# Altium schematic symbol library AliPadash.SchLib: 1117 symbols (part 5 of 6)
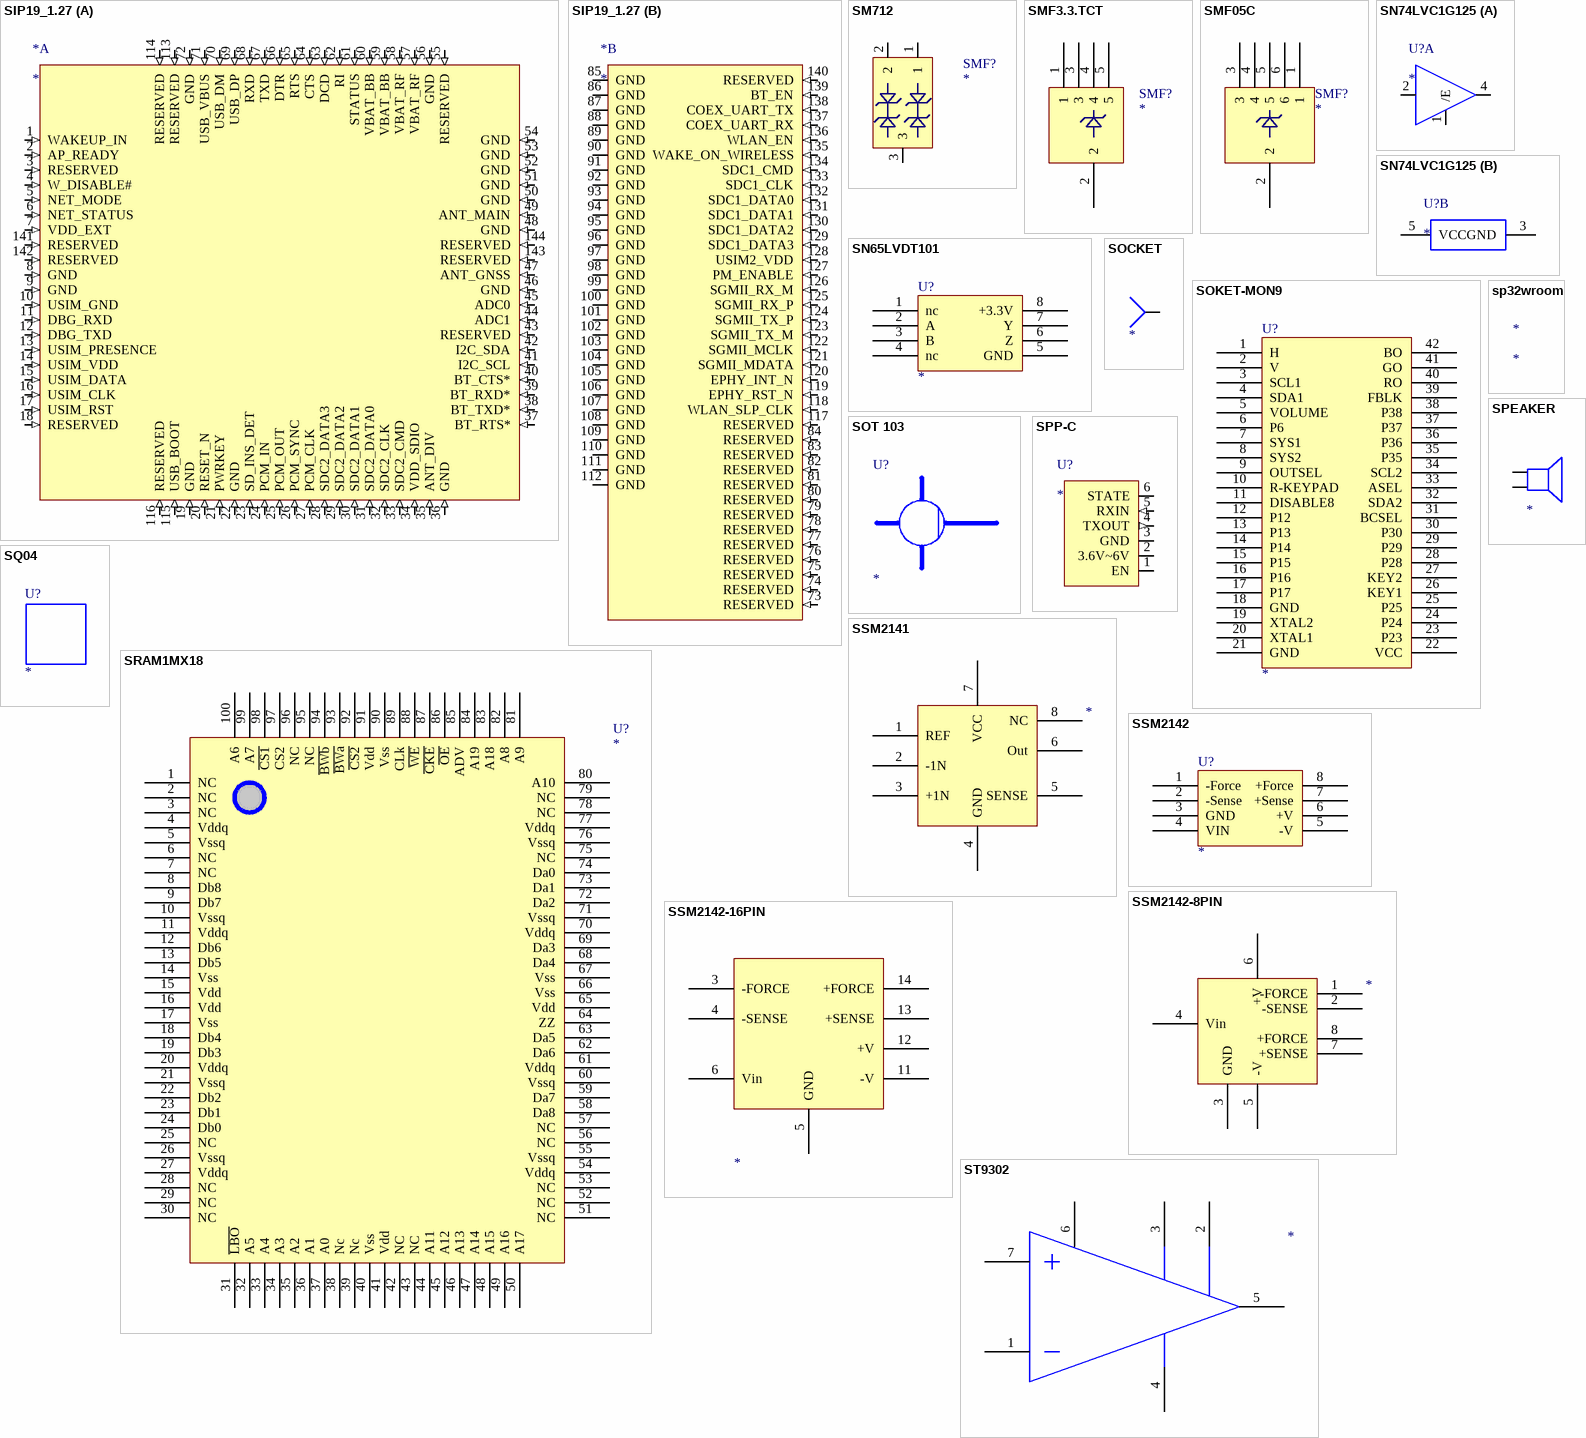
[diagram p87: symbols SIP19_1.27 to ST9302]

## SSM2142-16PIN
designator ?
U?
footprint DIP16
pins: 3 -FORCE, 4 -SENSE, 5 GND (power), 6 Vin, 11 -V, 12 +V, 13 +SENSE, 14 +FORCE

## ST9302
designator ?
pins: 1, 2, 3, 4, 5, 6, 7

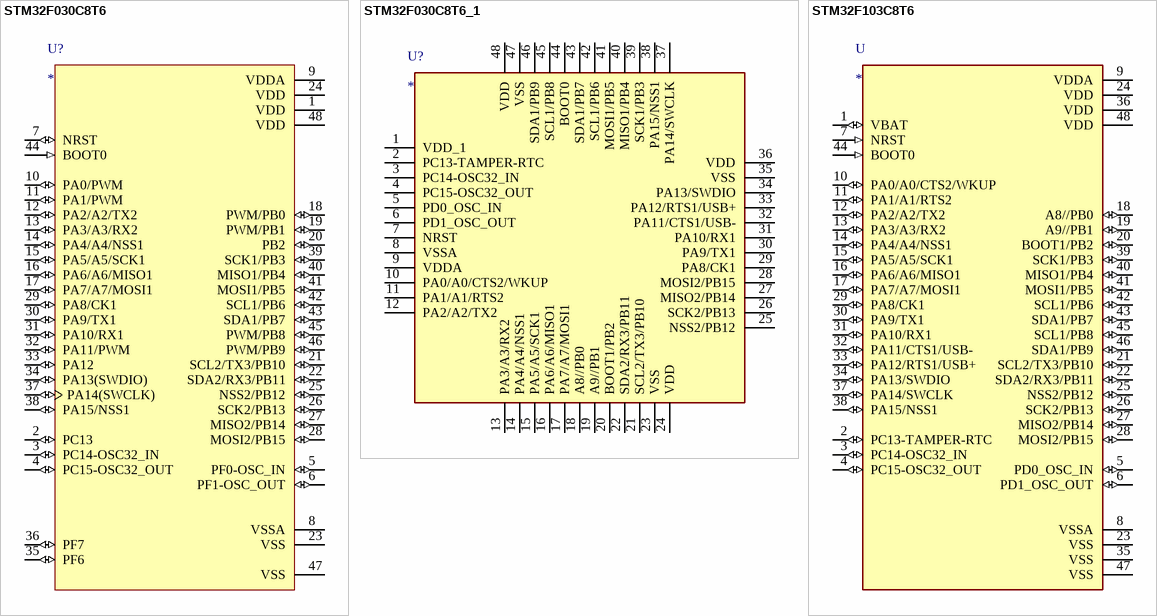
[diagram p58: symbols STM32F030C8T6 to STM32F103C8T6]

## STM32F030C8T6
designator U?
footprint LQFP48
pins: 1 VDD (power), 2 PC13 (io), 3 PC14-OSC32_IN (io), 4 PC15-OSC32_OUT (io), 5 PF0-OSC_IN (io), 6 PF1-OSC_OUT (io), 7 NRST (io), 8 VSSA (power), 9 VDDA (power), 10 PA0/PWM (io), 11 PA1/PWM (io), 12 PA2/A2/TX2 (io), 13 PA3/A3/RX2 (io), 14 PA4/A4/NSS1 (io), 15 PA5/A5/SCK1 (io), 16 PA6/A6/MISO1 (io), 17 PA7/A7/MOSI1 (io), 18 PWM/PB0 (io), 19 PWM/PB1 (io), 20 PB2 (io), 21 SCL2/TX3/PB10 (io), 22 SDA2/RX3/PB11 (io), 23 VSS (power), 24 VDD (power), 25 NSS2/PB12 (io), 26 SCK2/PB13 (io), 27 MISO2/PB14 (io), 28 MOSI2/PB15 (io), 29 PA8/CK1 (io), 30 PA9/TX1 (io), 31 PA10/RX1 (io), 32 PA11/PWM (io), 33 PA12 (io), 34 PA13(SWDIO) (io), 35 PF6 (io), 36 PF7 (io), 37 PA14(SWCLK) (io), 38 PA15/NSS1 (io), 39 SCK1/PB3 (io), 40 MISO1/PB4 (io), 41 MOSI1/PB5 (io), 42 SCL1/PB6 (io), 43 SDA1/PB7 (io), 44 BOOT0 (in), 45 PWM/PB8 (io), 46 PWM/PB9 (io), 47 VSS (power), 48 VDD (power)

## STM32F030C8T6_1
designator U?
footprint LQFP48
pins: 1 VDD_1, 2 PC13-TAMPER-RTC, 3 PC14-OSC32_IN, 4 PC15-OSC32_OUT, 5 PD0_OSC_IN, 6 PD1_OSC_OUT, 7 NRST, 8 VSSA, 9 VDDA, 10 PA0/A0/CTS2/WKUP, 11 PA1/A1/RTS2, 12 PA2/A2/TX2, 13 PA3/A3/RX2, 14 PA4/A4/NSS1, 15 PA5/A5/SCK1, 16 PA6/A6/MISO1, 17 PA7/A7/MOSI1, 18 A8//PB0, 19 A9//PB1, 20 BOOT1/PB2, 21 SCL2/TX3/PB10, 22 SDA2/RX3/PB11, 23 VSS, 24 VDD, 25 NSS2/PB12, 26 SCK2/PB13, 27 MISO2/PB14, 28 MOSI2/PB15, 29 PA8/CK1, 30 PA9/TX1, 31 PA10/RX1, 32 PA11/CTS1/USB-, 33 PA12/RTS1/USB+, 34 PA13/SWDIO, 35 VSS, 36 VDD, 37 PA14/SWCLK, 38 PA15/NSS1, 39 SCK1/PB3, 40 MISO1/PB4, 41 MOSI1/PB5, 42 SCL1/PB6, 43 SDA1/PB7, 44 BOOT0, 45 SCL1/PB8, 46 SDA1/PB9, 47 VSS, 48 VDD

## STM32F103C8T6
designator U
M3 STM32F1 Microcontroller IC 32-Bit 72MHz 64KB _64K x 8_ FLASH; MP: STM32F103C8T6; MF: STMicroelectronics; Price: None; Package: LQFP-48 STMicroelectronics; Value: *; Availability: Unavailable; SnapEDA_Link: https://www.snapeda.com/parts/STM32F103C8T6/STMicroelectronics/view-part/52195/?ref=snap
footprint QFP50P900X900X160-48N
pins: 1 VBAT (io), 2 PC13-TAMPER-RTC (io), 3 PC14-OSC32_IN (io), 4 PC15-OSC32_OUT (io), 5 PD0_OSC_IN (io), 6 PD1_OSC_OUT (io), 7 NRST (in), 8 VSSA (power), 9 VDDA (power), 10 PA0/A0/CTS2/WKUP (io), 11 PA1/A1/RTS2 (io), 12 PA2/A2/TX2 (io), 13 PA3/A3/RX2 (io), 14 PA4/A4/NSS1 (io), 15 PA5/A5/SCK1 (io), 16 PA6/A6/MISO1 (io), 17 PA7/A7/MOSI1 (io), 18 A8//PB0 (io), 19 A9//PB1 (io), 20 BOOT1/PB2 (io), 21 SCL2/TX3/PB10 (io), 22 SDA2/RX3/PB11 (io), 23 VSS (power), 24 VDD (power), 25 NSS2/PB12 (io), 26 SCK2/PB13 (io), 27 MISO2/PB14 (io), 28 MOSI2/PB15 (io), 29 PA8/CK1 (io), 30 PA9/TX1 (io), 31 PA10/RX1 (io), 32 PA11/CTS1/USB- (io), 33 PA12/RTS1/USB+ (io), 34 PA13/SWDIO (io), 35 VSS (power), 36 VDD (power), 37 PA14/SWCLK (io), 38 PA15/NSS1 (io), 39 SCK1/PB3 (io), 40 MISO1/PB4 (io), 41 MOSI1/PB5 (io), 42 SCL1/PB6 (io), 43 SDA1/PB7 (io), 44 BOOT0 (in), 45 SCL1/PB8 (io), 46 SDA1/PB9 (io), 47 VSS (power), 48 VDD (power)

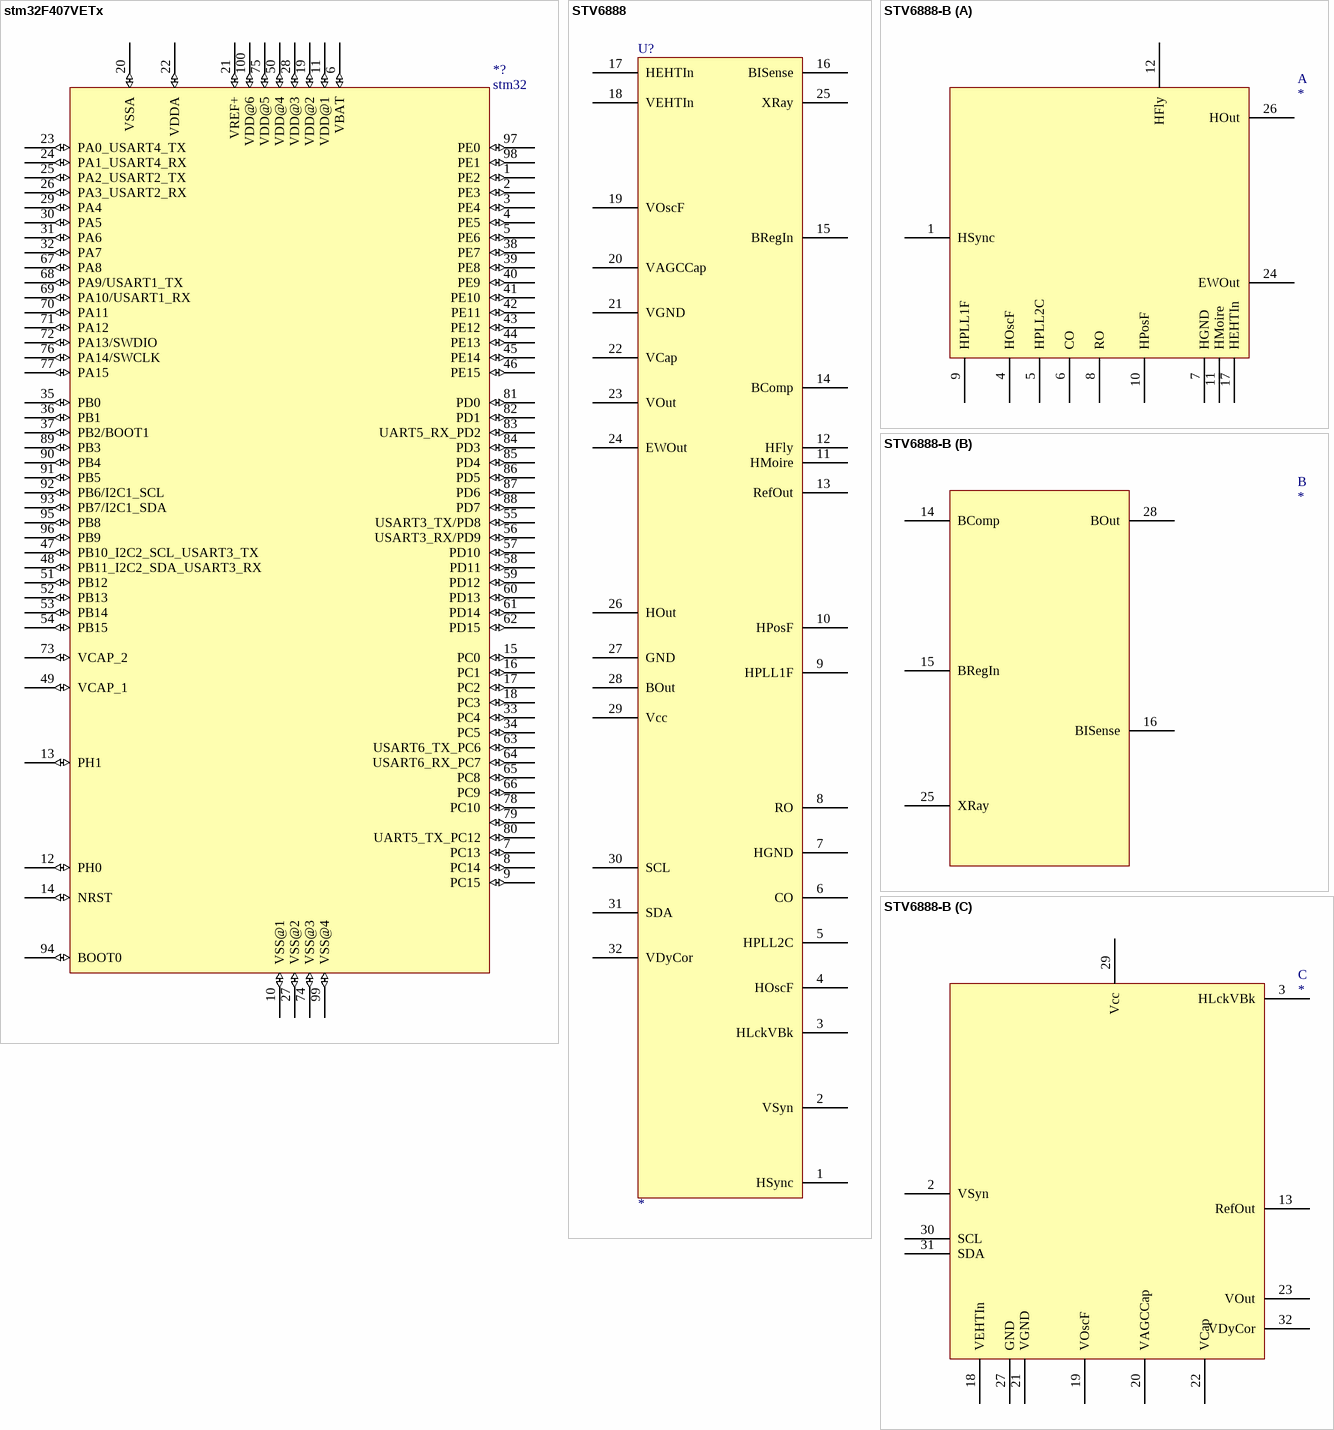
[diagram p59: symbols stm32F407VETx to STV6888-B]

## stm32F407VETx
designator *?, comment stm32
footprint LQFP100
footprint LQFP100
pins: 1 PE2 (io), 2 PE3 (io), 3 PE4 (io), 4 PE5 (io), 5 PE6 (io), 6 VBAT (io), 7 PC13 (io), 8 PC14 (io), 9 PC15 (io), 10 VSS@1 (io), 11 VDD@1 (io), 12 PH0 (io), 13 PH1 (io), 14 NRST (io), 15 PC0 (io), 16 PC1 (io), 17 PC2 (io), 18 PC3 (io), 19 VDD@2 (io), 20 VSSA (io), 21 VREF+ (io), 22 VDDA (io), 23 PA0_USART4_TX (io), 24 PA1_USART4_RX (io), 25 PA2_USART2_TX (io), 26 PA3_USART2_RX (io), 27 VSS@2 (io), 28 VDD@3 (io), 29 PA4 (io), 30 PA5 (io), 31 PA6 (io), 32 PA7 (io), 33 PC4 (io), 34 PC5 (io), 35 PB0 (io), 36 PB1 (io), 37 PB2/BOOT1 (io), 38 PE7 (io), 39 PE8 (io), 40 PE9 (io), 41 PE10 (io), 42 PE11 (io), 43 PE12 (io), 44 PE13 (io), 45 PE14 (io), 46 PE15 (io), 47 PB10_I2C2_SCL_USART3_TX (io), 48 PB11_I2C2_SDA_USART3_RX (io), 49 VCAP_1 (io), 50 VDD@4 (io), 51 PB12 (io), 52 PB13 (io), 53 PB14 (io), 54 PB15 (io), 55 USART3_TX/PD8 (io), 56 USART3_RX/PD9 (io), 57 PD10 (io), 58 PD11 (io), 59 PD12 (io), 60 PD13 (io), 61 PD14 (io), 62 PD15 (io), 63 USART6_TX_PC6 (io), 64 USART6_RX_PC7 (io), 65 PC8 (io), 66 PC9 (io), 67 PA8 (io), 68 PA9/USART1_TX (io), 69 PA10/USART1_RX (io), 70 PA11 (io), 71 PA12 (io), 72 PA13/SWDIO (io), 73 VCAP_2 (io), 74 VSS@3 (io), 75 VDD@5 (io), 76 PA14/SWCLK (io), 77 PA15 (io), 78 PC10 (io), 79 PC11 (io), 80 UART5_TX_PC12 (io), 81 PD0 (io), 82 PD1 (io), 83 UART5_RX_PD2 (io), 84 PD3 (io), 85 PD4 (io), 86 PD5 (io), 87 PD6 (io), 88 PD7 (io), 89 PB3 (io), 90 PB4 (io), 91 PB5 (io), 92 PB6/I2C1_SCL (io), 93 PB7/I2C1_SDA (io), 94 BOOT0 (io), 95 PB8 (io), 96 PB9 (io), 97 PE0 (io), 98 PE1 (io), 99 VSS@4 (io), 100 VDD@6 (io)

## STV6888
designator U?
pins: 1 HSync, 2 VSyn, 3 HLckVBk, 4 HOscF, 5 HPLL2C, 6 CO, 7 HGND, 8 RO, 9 HPLL1F, 10 HPosF, 11 HMoire, 12 HFly, 13 RefOut, 14 BComp, 15 BRegIn, 16 BISense, 17 HEHTIn, 18 VEHTIn, 19 VOscF, 20 VAGCCap, 21 VGND, 22 VCap, 23 VOut, 24 EWOut, 25 XRay, 26 HOut, 27 GND, 28 BOut, 29 Vcc, 30 SCL, 31 SDA, 32 VDyCor

## STV6888-B
designator ?
part A pins: 1 HSync, 4 HOscF, 5 HPLL2C, 6 CO, 7 HGND, 8 RO, 9 HPLL1F, 10 HPosF, 11 HMoire, 12 HFly, 17 HEHTIn, 24 EWOut, 26 HOut
part B pins: 14 BComp, 15 BRegIn, 16 BISense, 25 XRay, 28 BOut
part C pins: 2 VSyn, 3 HLckVBk, 13 RefOut, 18 VEHTIn, 19 VOscF, 20 VAGCCap, 21 VGND, 22 VCap, 23 VOut, 27 GND, 29 Vcc, 30 SCL, 31 SDA, 32 VDyCor

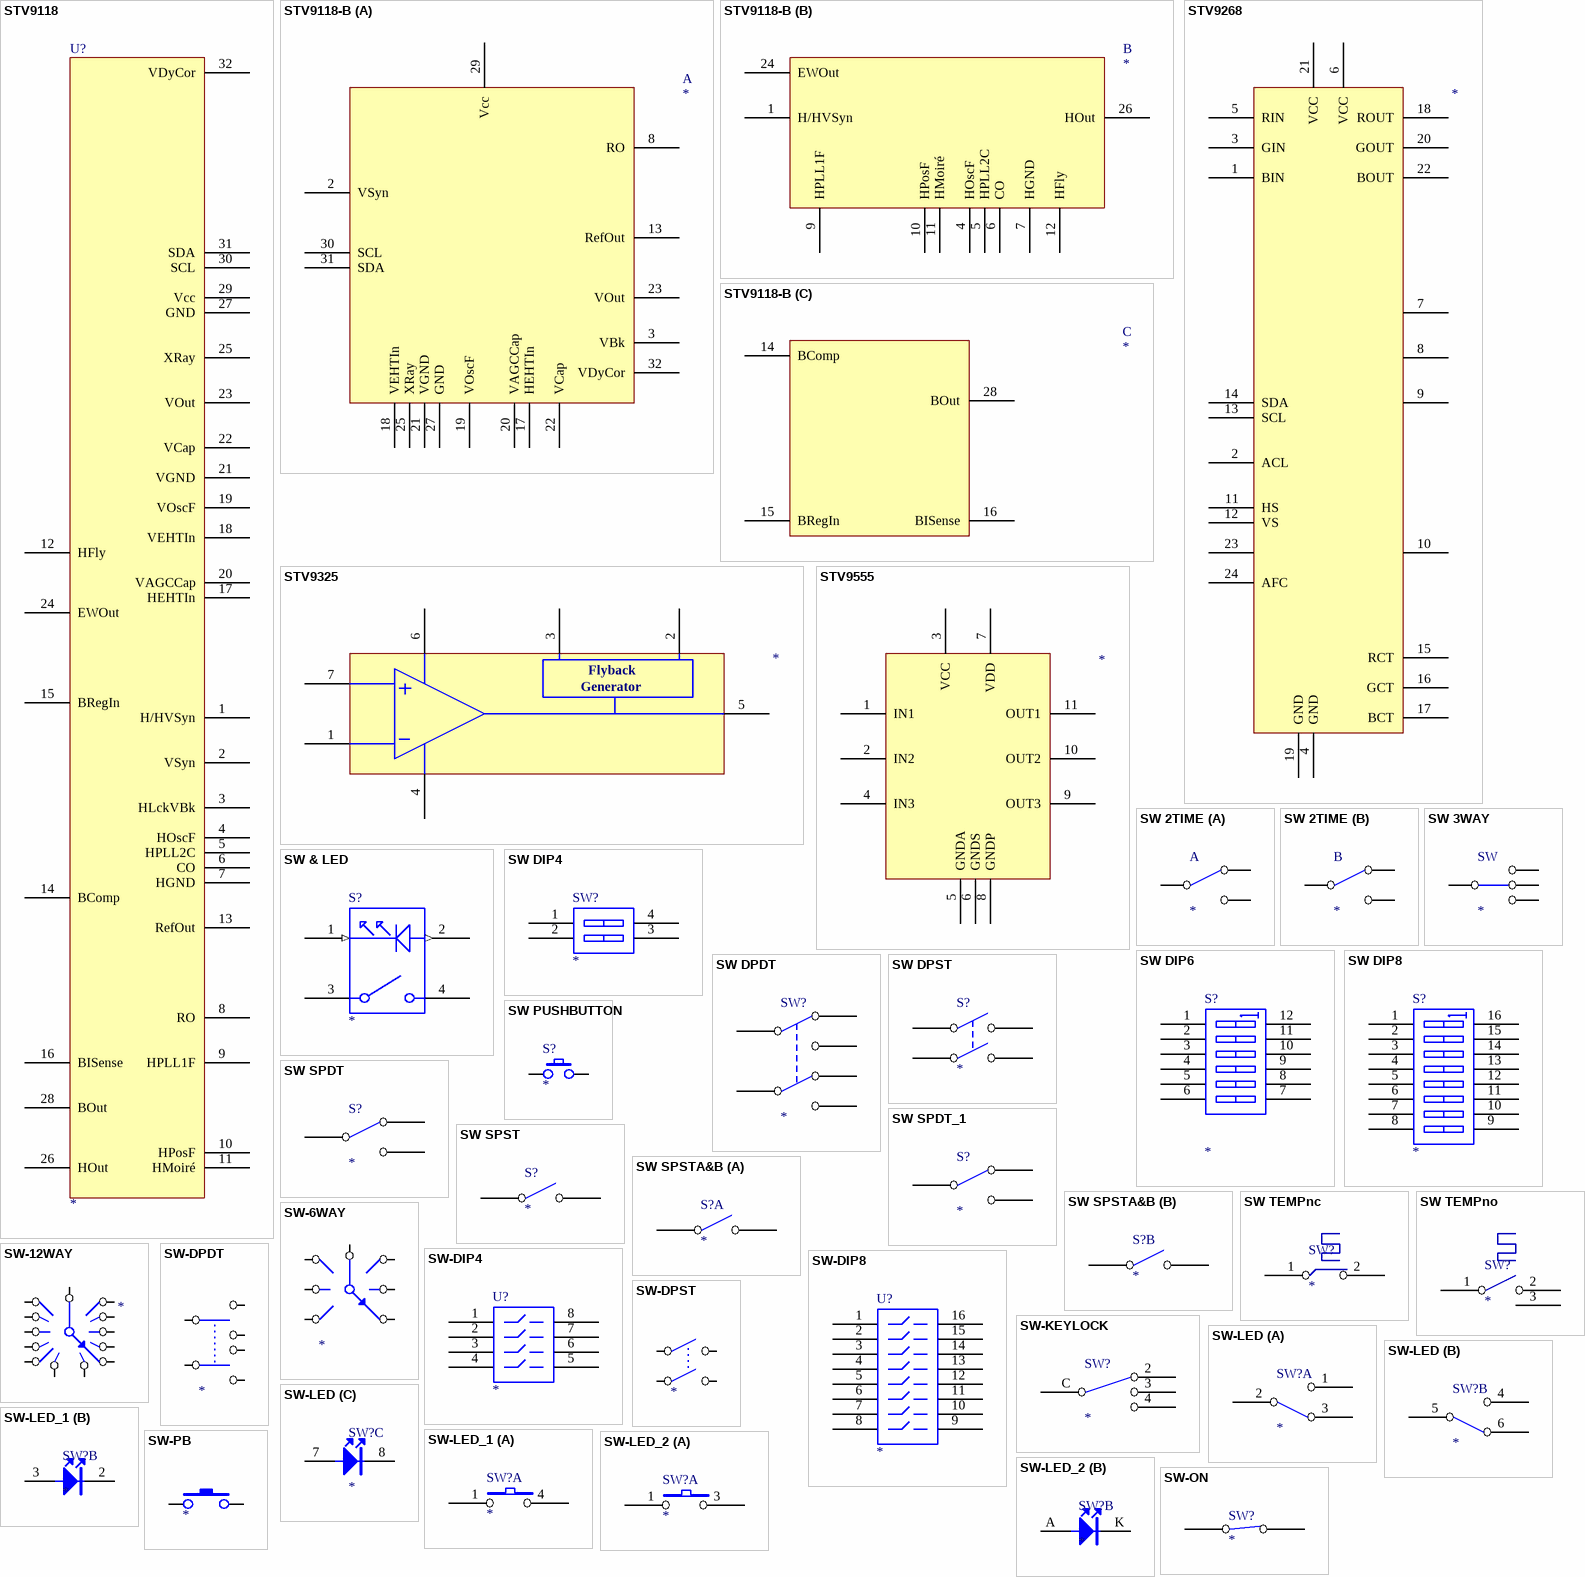
[diagram p60: symbols STV9118 to SW-PB]

## STV9118
designator U?
pins: 1 H/HVSyn, 2 VSyn, 3 HLckVBk, 4 HOscF, 5 HPLL2C, 6 CO, 7 HGND, 8 RO, 9 HPLL1F, 10 HPosF, 11 HMoiré, 12 HFly, 13 RefOut, 14 BComp, 15 BRegIn, 16 BISense, 17 HEHTIn, 18 VEHTIn, 19 VOscF, 20 VAGCCap, 21 VGND, 22 VCap, 23 VOut, 24 EWOut, 25 XRay, 26 HOut, 27 GND, 28 BOut, 29 Vcc, 30 SCL, 31 SDA, 32 VDyCor

## STV9118-B
designator ?
part A pins: 2 VSyn, 3 VBk, 8 RO, 13 RefOut, 17 HEHTIn, 18 VEHTIn, 19 VOscF, 20 VAGCCap, 21 VGND, 22 VCap, 23 VOut, 25 XRay, 27 GND, 29 Vcc, 30 SCL, 31 SDA, 32 VDyCor
part B pins: 1 H/HVSyn, 4 HOscF, 5 HPLL2C, 6 CO, 7 HGND, 9 HPLL1F, 10 HPosF, 11 HMoiré, 12 HFly, 24 EWOut, 26 HOut
part C pins: 14 BComp, 15 BRegIn, 16 BISense, 28 BOut

## STV9268
designator ?
pins: 1 BIN, 2 ACL, 3 GIN, 4 GND, 5 RIN, 6 VCC, 7, 8, 9, 10, 11 HS, 12 VS, 13 SCL, 14 SDA, 15 RCT, 16 GCT, 17 BCT, 18 ROUT, 19 GND, 20 GOUT, 21 VCC, 22 BOUT, 23, 24 AFC

## STV9325
designator ?
pins: 1, 2, 3, 4, 5, 6, 7
text: Flyback; Generator

## STV9555
designator ?
pins: 1 IN1, 2 IN2, 3 VCC, 4 IN3, 5 GNDA, 6 GNDS, 7 VDD, 8 GNDP, 9 OUT3, 10 OUT2, 11 OUT1

## SW 2TIME
designator ?
footprint sw6p
part A pins: 1, 2, 3, G GND hidden to GND
part B pins: 4, 5, 6

## SW 3WAY
designator SW
footprint IDC6
pins: 1, 3, 4, 5

## SW & LED
designator S?
pins: 1 (in), 2 (out), 3, 4

## SW DIP4
designator SW?
footprint SWDIP4
pins: 1 A1, 2 A2, 3 A3, 4 A4

## SW DIP6
designator S?
pins: 1 A1, 2 A2, 3 A3, 4 A4, 5 A5, 6 A6, 7 B6, 8 B5, 9 B4, 10 B3, 11 B2, 12 B1

## SW DIP8
designator S?
pins: 1 A1, 2 A2, 3 A3, 4 A4, 5 A5, 6 A6, 7 A7, 8 A8, 9 B8, 10 B7, 11 B6, 12 B5, 13 B4, 14 B3, 15 B2, 16 B1

## SW DPDT
designator SW?
footprint SW-MICRO6
pins: A1 COMMON1, A2 NC1, A3 NO1, B1 COMMON2, B2 NC2, B3 NO2

## SW DPST
designator S?
pins: COMMON1, COMMON2, NO1, NO2

## SW PUSHBUTTON
designator S?
footprint PB_ST
pins: 1, 2

## SW SPDT
designator S?
pins: 1 NO, 2 COMMON, 3 NC

## SW SPDT_1
designator S?
pins: 1 NO, 2 COMMON, 3 NC

## SW SPST
designator S?
pins: COMMON, NO

## SW SPSTA&B
designator S?
part A pins: 1 COMMON, 4 NO
part B pins: 2 COMMON, 3 NO

## SW TEMPnc
designator SW?
pins: 1, 2

## SW TEMPno
designator SW?
pins: 1, 2, 3

## SW-6WAY
designator ?
pins: 1, 2, 3, 4, 5, 6, 7

## SW-12WAY
designator ?
pins: 1, 2, 3, 4, 5, 6, 7, 8, 9, 10, 11, 12, 13

## SW-DIP4
designator U?
footprint SWDIP8
pins: 1, 2, 3, 4, 5, 6, 7, 8

## SW-DIP8
designator U?
footprint DIP16
pins: 1, 2, 3, 4, 5, 6, 7, 8, 9, 10, 11, 12, 13, 14, 15, 16

## SW-DPDT
designator ?
pins: 1, 2, 3, 4, 5, 6

## SW-DPST
designator ?
pins: 1, 2, 3, 4

## SW-KEYLOCK
designator SW?
footprint SW-KEYLOCK
pins: 2, 3, 4, C

## SW-LED
designator SW?
footprint SW-LED
part A pins: 1, 2, 3
part B pins: 4, 5, 6
part C pins: 7, 8

## SW-LED_1
designator SW?
footprint ILLUMEC-4F
part A pins: 1, 4
part B pins: 2, 3

## SW-LED_2
designator SW?
footprint B3W-9
part A pins: 1, 3
part B pins: A, K

## SW-ON
designator SW?
pins: 1, 2

## SW-PB
designator ?
pins: 1, 2

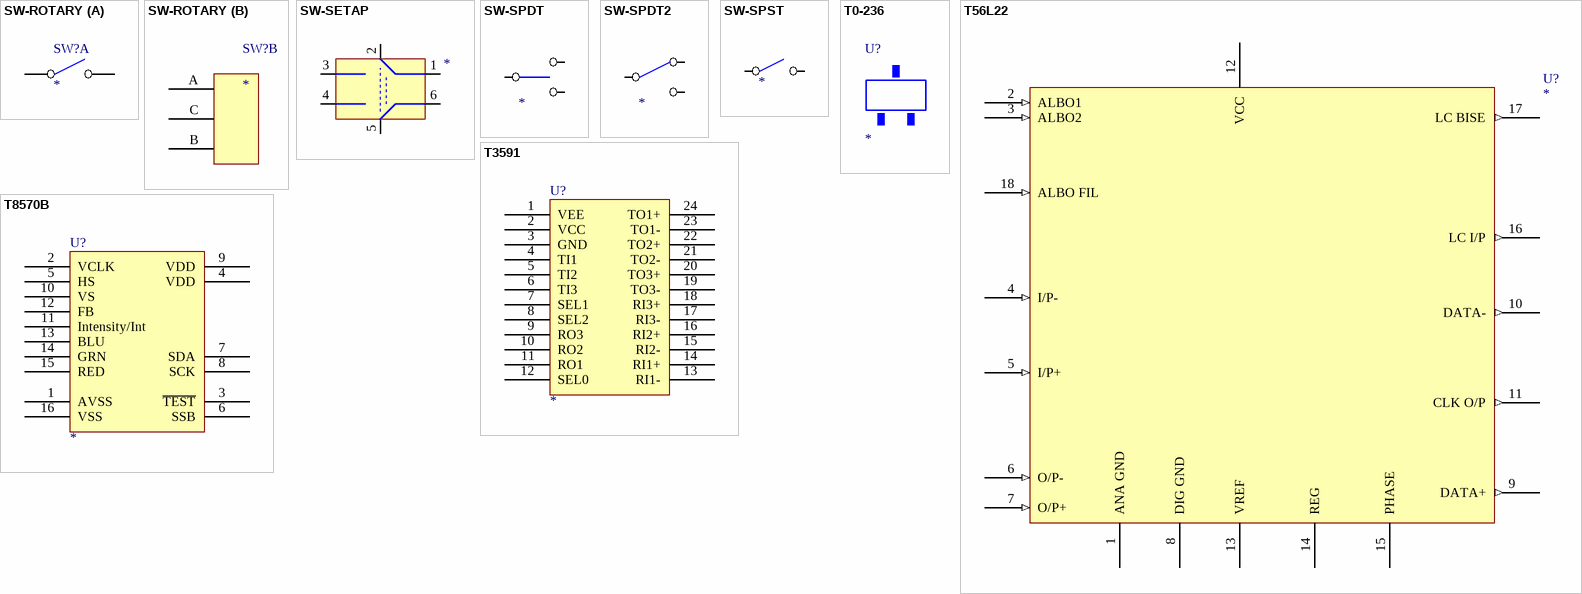
[diagram p61: symbols SW-ROTARY to T8570B]

## SW-ROTARY
designator SW?
footprint RE11
part A pins: 1 COMMON, 2 NO
part B pins: A, B, C

## SW-SETAP
designator ?
pins: 1, 2, 3, 4, 5, 6

## SW-SPDT
designator ?
pins: 1, 2, 3

## SW-SPDT2
designator ?
pins: 1, 2, 3

## SW-SPST
designator ?
pins: 1, 2

## T0-236
designator U?

## T56L22
designator U?
pins: 1 ANA GND, 2 ALBO1 (in), 3 ALBO2 (in), 4 I/P- (in), 5 I/P+ (in), 6 O/P- (in), 7 O/P+ (in), 8 DIG GND, 9 DATA+ (out), 10 DATA- (out), 11 CLK O/P (out), 12 VCC, 13 VREF, 14 REG, 15 PHASE, 16 LC I/P (out), 17 LC BISE (out), 18 ALBO FIL (in)

## T3591
designator U?
footprint SOI-24
pins: 1 VEE, 2 VCC, 3 GND, 4 TI1, 5 TI2, 6 TI3, 7 SEL1, 8 SEL2, 9 RO3, 10 RO2, 11 RO1, 12 SEL0, 13 RI1-, 14 RI1+, 15 RI2-, 16 RI2+, 17 RI3-, 18 RI3+, 19 TO3-, 20 TO3+, 21 TO2-, 22 TO2+, 23 TO1-, 24 TO1+

## T8570B
designator U?
footprint SO-16
footprint DIP16
pins: 1 AVSS, 2 VCLK, 3 ~{TEST}, 4 VDD, 5 HS, 6 SSB, 7 SDA, 8 SCK, 9 VDD, 10 VS, 11 Intensity/Int, 12 FB, 13 BLU, 14 GRN, 15 RED, 16 VSS

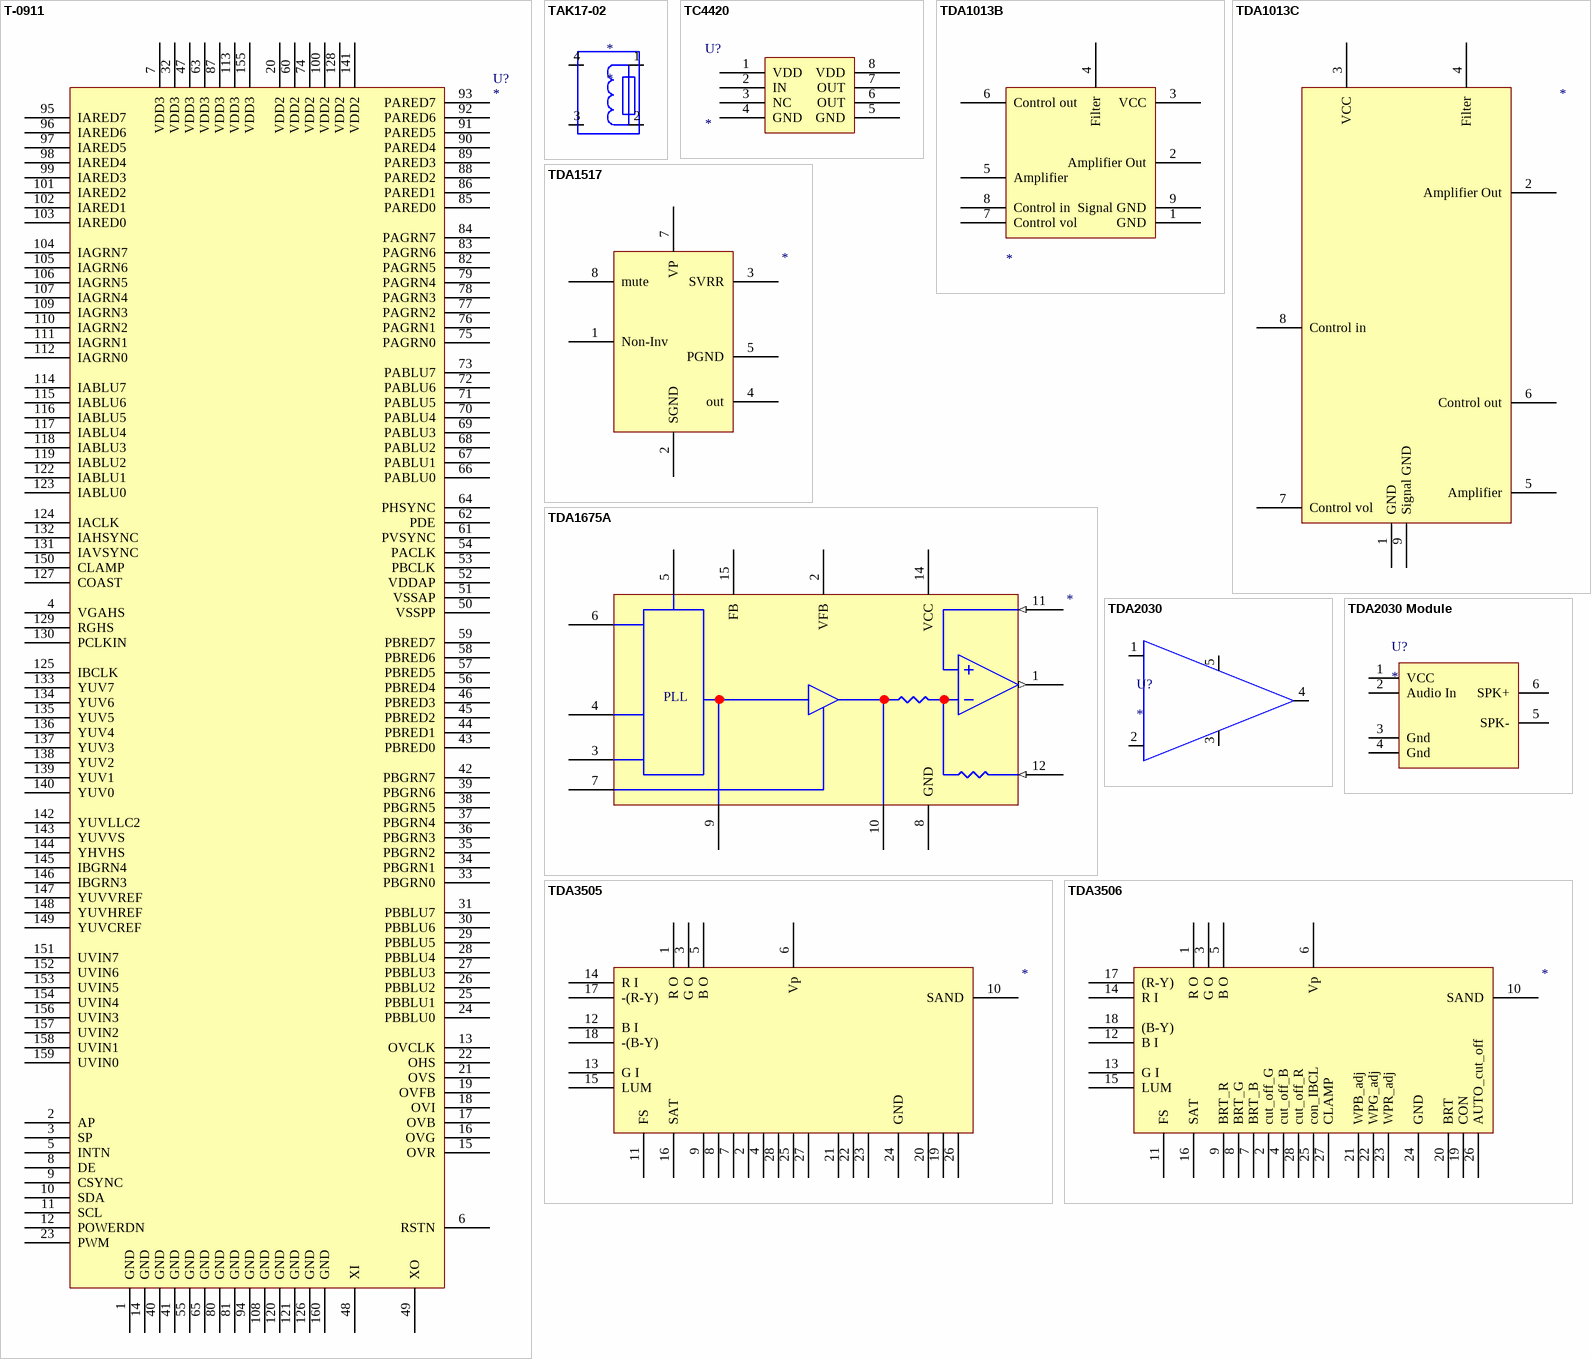
[diagram p62: symbols T-0911 to TDA3506]

## T-0911
designator U?
footprint PQFP160
pins: 1 GND, 2 AP, 3 SP, 4 VGAHS, 5 INTN, 6 RSTN, 7 VDD3, 8 DE, 9 CSYNC, 10 SDA, 11 SCL, 12 POWERDN, 13 OVCLK, 14 GND, 15 OVR, 16 OVG, 17 OVB, 18 OVI, 19 OVFB, 20 VDD2, 21 OVS, 22 OHS, 23 PWM, 24 PBBLU0, 25 PBBLU1, 26 PBBLU2, 27 PBBLU3, 28 PBBLU4, 29 PBBLU5, 30 PBBLU6, 31 PBBLU7, 32 VDD3, 33 PBGRN0, 34 PBGRN1, 35 PBGRN2, 36 PBGRN3, 37 PBGRN4, 38 PBGRN5, 39 PBGRN6, 40 GND, 41 GND, 42 PBGRN7, 43 PBRED0, 44 PBRED1, 45 PBRED2, 46 PBRED3, 47 VDD3, 48 XI, 49 XO, 50 VSSPP, 51 VSSAP, 52 VDDAP, 53 PBCLK, 54 PACLK, 55 GND, 56 PBRED4, 57 PBRED5, 58 PBRED6, 59 PBRED7, 60 VDD2, 61 PVSYNC, 62 PDE, 63 VDD3, 64 PHSYNC, 65 GND, 66 PABLU0, 67 PABLU1, 68 PABLU2, 69 PABLU3, 70 PABLU4, 71 PABLU5, 72 PABLU6, 73 PABLU7, 74 VDD2, 75 PAGRN0, 76 PAGRN1, 77 PAGRN2, 78 PAGRN3, 79 PAGRN4, 80 GND, 81 GND, 82 PAGRN5, 83 PAGRN6, 84 PAGRN7, 85 PARED0, 86 PARED1, 87 VDD3, 88 PARED2, 89 PARED3, 90 PARED4, 91 PARED5, 92 PARED6, 93 PARED7, 94 GND, 95 IARED7, 96 IARED6, 97 IARED5, 98 IARED4, 99 IARED3, 100 VDD2, 101 IARED2, 102 IARED1, 103 IARED0, 104 IAGRN7, 105 IAGRN6, 106 IAGRN5, 107 IAGRN4, 108 GND, 109 IAGRN3, 110 IAGRN2, 111 IAGRN1, 112 IAGRN0, 113 VDD3, 114 IABLU7, 115 IABLU6, 116 IABLU5, 117 IABLU4, 118 IABLU3, 119 IABLU2, 120 GND, 121 GND, 122 IABLU1, 123 IABLU0, 124 IACLK, 125 IBCLK, 126 GND, 127 COAST, 128 VDD2, 129 RGHS, 130 PCLKIN, 131 IAVSYNC, 132 IAHSYNC, 133 YUV7, 134 YUV6, 135 YUV5, 136 YUV4, 137 YUV3, 138 YUV2, 139 YUV1, 140 YUV0, 141 VDD2, 142 YUVLLC2, 143 YUVVS, 144 YHVHS, 145 IBGRN4, 146 IBGRN3, 147 YUVVREF, 148 YUVHREF, 149 YUVCREF, 150 CLAMP, 151 UVIN7, 152 UVIN6, 153 UVIN5, 154 UVIN4, 155 VDD3, 156 UVIN3, 157 UVIN2, 158 UVIN1, 159 UVIN0, 160 GND

## TAK17-02
designator *
footprint TAK17
pins: 1, 2, 3, 4

## TC4420
designator U?
footprint DIP8
pins: 1 VDD, 2 IN, 3 NC, 4 GND, 5 GND, 6 OUT, 7 OUT, 8 VDD

## TDA1013B
designator ?
pins: 1 GND, 2 Amplifier Out, 3 VCC, 4 Filter, 5 Amplifier, 6 Control out, 7 Control vol, 8 Control in, 9 Signal GND

## TDA1013C
designator ?
pins: 1 GND, 2 Amplifier Out, 3 VCC, 4 Filter, 5 Amplifier, 6 Control out, 7 Control vol, 8 Control in, 9 Signal GND

## TDA1517
designator ?
pins: 1 Non-Inv, 2 SGND, 3 SVRR, 4 out, 5 PGND, 7 VP, 8 mute

## TDA1675A
designator ?
pins: 1 (out), 2 VFB, 3, 4, 5, 6, 7, 8 GND, 9, 10, 11 (in), 12 (in), 14 VCC, 15 FB
text: PLL

## TDA2030
designator U?
footprint Pentawatt5PIN (Footprint not found)
pins: 1, 2, 3, 4, 5

## TDA2030 Module
designator U?
pins: 1 VCC, 2 Audio In, 3 Gnd, 4 Gnd, 5 SPK-, 6 SPK+

## TDA3505
designator ?
pins: 1 R O, 2, 3 G O, 4, 5 B O, 6 Vp, 7, 8, 9, 10 SAND, 11 FS, 12 B I, 13 G I, 14 R I, 15 LUM, 16 SAT, 17 -(R-Y), 18 -(B-Y), 19, 20, 21, 22, 23, 24 GND, 25, 26, 27, 28

## TDA3506
designator ?
pins: 1 R O, 2 cut_off_G, 3 G O, 4 cut_off_B, 5 B O, 6 Vp, 7 BRT_B, 8 BRT_G, 9 BRT_R, 10 SAND, 11 FS, 12 B I, 13 G I, 14 R I, 15 LUM, 16 SAT, 17 (R-Y), 18 (B-Y), 19 CON, 20 BRT, 21 WPB_adj, 22 WPG_adj, 23 WPR_adj, 24 GND, 25 con_IBCL, 26 AUTO_cut_off, 27 CLAMP, 28 cut_off_R

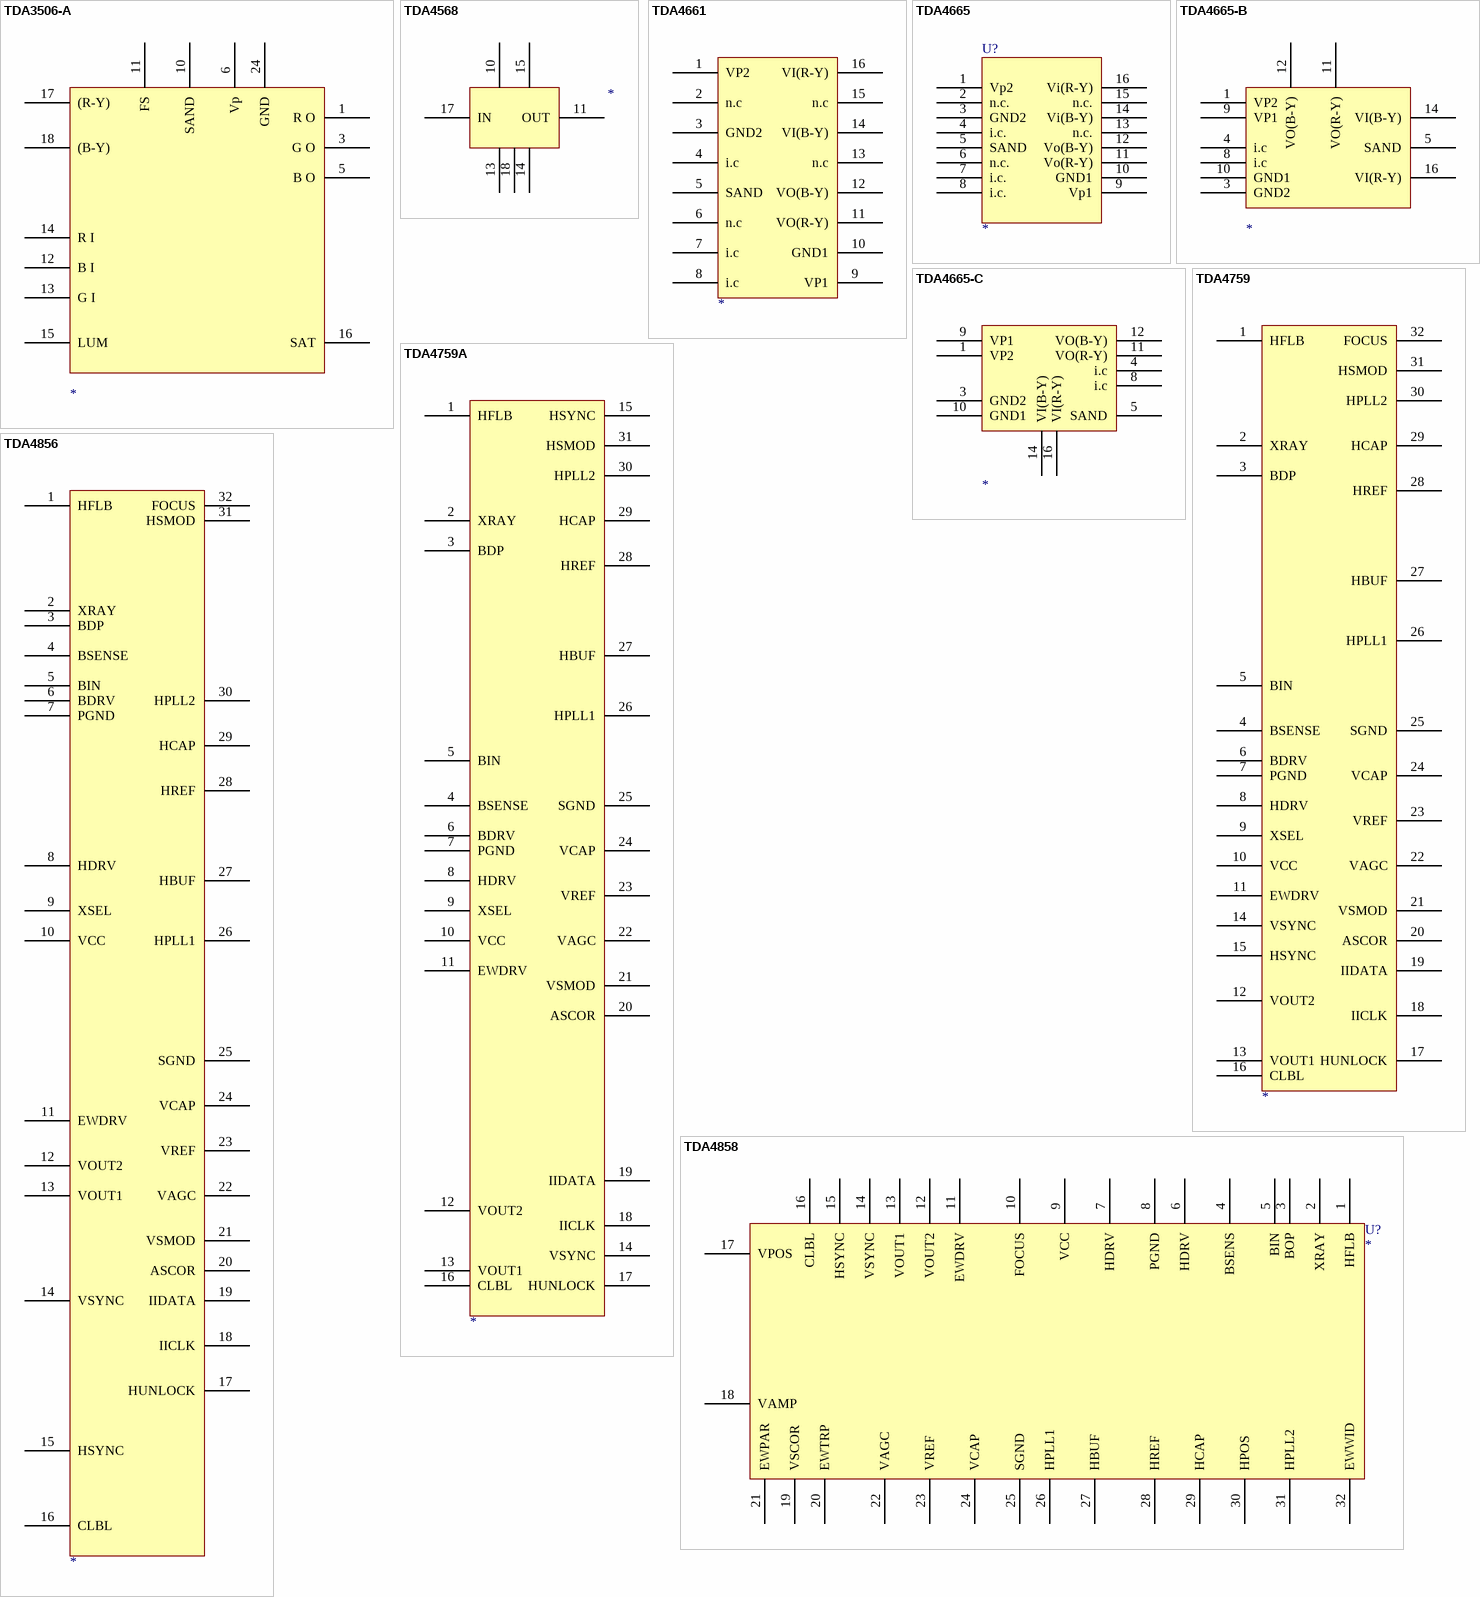
[diagram p63: symbols TDA3506-A to TDA4858]

## TDA3506-A
designator ?
pins: 1 R O, 3 G O, 5 B O, 6 Vp, 10 SAND, 11 FS, 12 B I, 13 G I, 14 R I, 15 LUM, 16 SAT, 17 (R-Y), 18 (B-Y), 24 GND

## TDA4568
designator ?
pins: 10, 11 OUT, 13, 14, 15, 17 IN, 18

## TDA4661
designator ?
pins: 1 VP2, 2 n.c, 3 GND2, 4 i.c, 5 SAND, 6 n.c, 7 i.c, 8 i.c, 9 VP1, 10 GND1, 11 VO(R-Y), 12 VO(B-Y), 13 n.c, 14 VI(B-Y), 15 n.c, 16 VI(R-Y)

## TDA4665
designator U?
Text Field1: Baseband delay line; Text Field2: Supersedes data of 1995 Oct 30; Text Field3: PHILIPS
footprint DIP16
pins: 1 Vp2, 2 n.c., 3 GND2, 4 i.c., 5 SAND, 6 n.c., 7 i.c., 8 i.c., 9 Vp1, 10 GND1, 11 Vo(R-Y), 12 Vo(B-Y), 13 n.c., 14 Vi(B-Y), 15 n.c., 16 Vi(R-Y)

## TDA4665-B
designator ?
pins: 1 VP2, 3 GND2, 4 i.c, 5 SAND, 8 i.c, 9 VP1, 10 GND1, 11 VO(R-Y), 12 VO(B-Y), 14 VI(B-Y), 16 VI(R-Y)

## TDA4665-C
designator ?
pins: 1 VP2, 3 GND2, 4 i.c, 5 SAND, 8 i.c, 9 VP1, 10 GND1, 11 VO(R-Y), 12 VO(B-Y), 14 VI(B-Y), 16 VI(R-Y)

## TDA4759
designator ?
pins: 1 HFLB, 2 XRAY, 3 BDP, 4 BSENSE, 5 BIN, 6 BDRV, 7 PGND, 8 HDRV, 9 XSEL, 10 VCC, 11 EWDRV, 12 VOUT2, 13 VOUT1, 14 VSYNC, 15 HSYNC, 16 CLBL, 17 HUNLOCK, 18 IICLK, 19 IIDATA, 20 ASCOR, 21 VSMOD, 22 VAGC, 23 VREF, 24 VCAP, 25 SGND, 26 HPLL1, 27 HBUF, 28 HREF, 29 HCAP, 30 HPLL2, 31 HSMOD, 32 FOCUS

## TDA4759A
designator ?
pins: 1 HFLB, 2 XRAY, 3 BDP, 4 BSENSE, 5 BIN, 6 BDRV, 7 PGND, 8 HDRV, 9 XSEL, 10 VCC, 11 EWDRV, 12 VOUT2, 13 VOUT1, 14 VSYNC, 15 HSYNC, 16 CLBL, 17 HUNLOCK, 18 IICLK, 19 IIDATA, 20 ASCOR, 21 VSMOD, 22 VAGC, 23 VREF, 24 VCAP, 25 SGND, 26 HPLL1, 27 HBUF, 28 HREF, 29 HCAP, 30 HPLL2, 31 HSMOD

## TDA4856
designator ?
pins: 1 HFLB, 2 XRAY, 3 BDP, 4 BSENSE, 5 BIN, 6 BDRV, 7 PGND, 8 HDRV, 9 XSEL, 10 VCC, 11 EWDRV, 12 VOUT2, 13 VOUT1, 14 VSYNC, 15 HSYNC, 16 CLBL, 17 HUNLOCK, 18 IICLK, 19 IIDATA, 20 ASCOR, 21 VSMOD, 22 VAGC, 23 VREF, 24 VCAP, 25 SGND, 26 HPLL1, 27 HBUF, 28 HREF, 29 HCAP, 30 HPLL2, 31 HSMOD, 32 FOCUS

## TDA4858
designator U?
pins: 1 HFLB, 2 XRAY, 3 BOP, 4 BSENS, 5 BIN, 6 HDRV, 7 HDRV, 8 PGND, 9 VCC, 10 FOCUS, 11 EWDRV, 12 VOUT2, 13 VOUT1, 14 VSYNC, 15 HSYNC, 16 CLBL, 17 VPOS, 18 VAMP, 19 VSCOR, 20 EWTRP, 21 EWPAR, 22 VAGC, 23 VREF, 24 VCAP, 25 SGND, 26 HPLL1, 27 HBUF, 28 HREF, 29 HCAP, 30 HPOS, 31 HPLL2, 32 EWWID

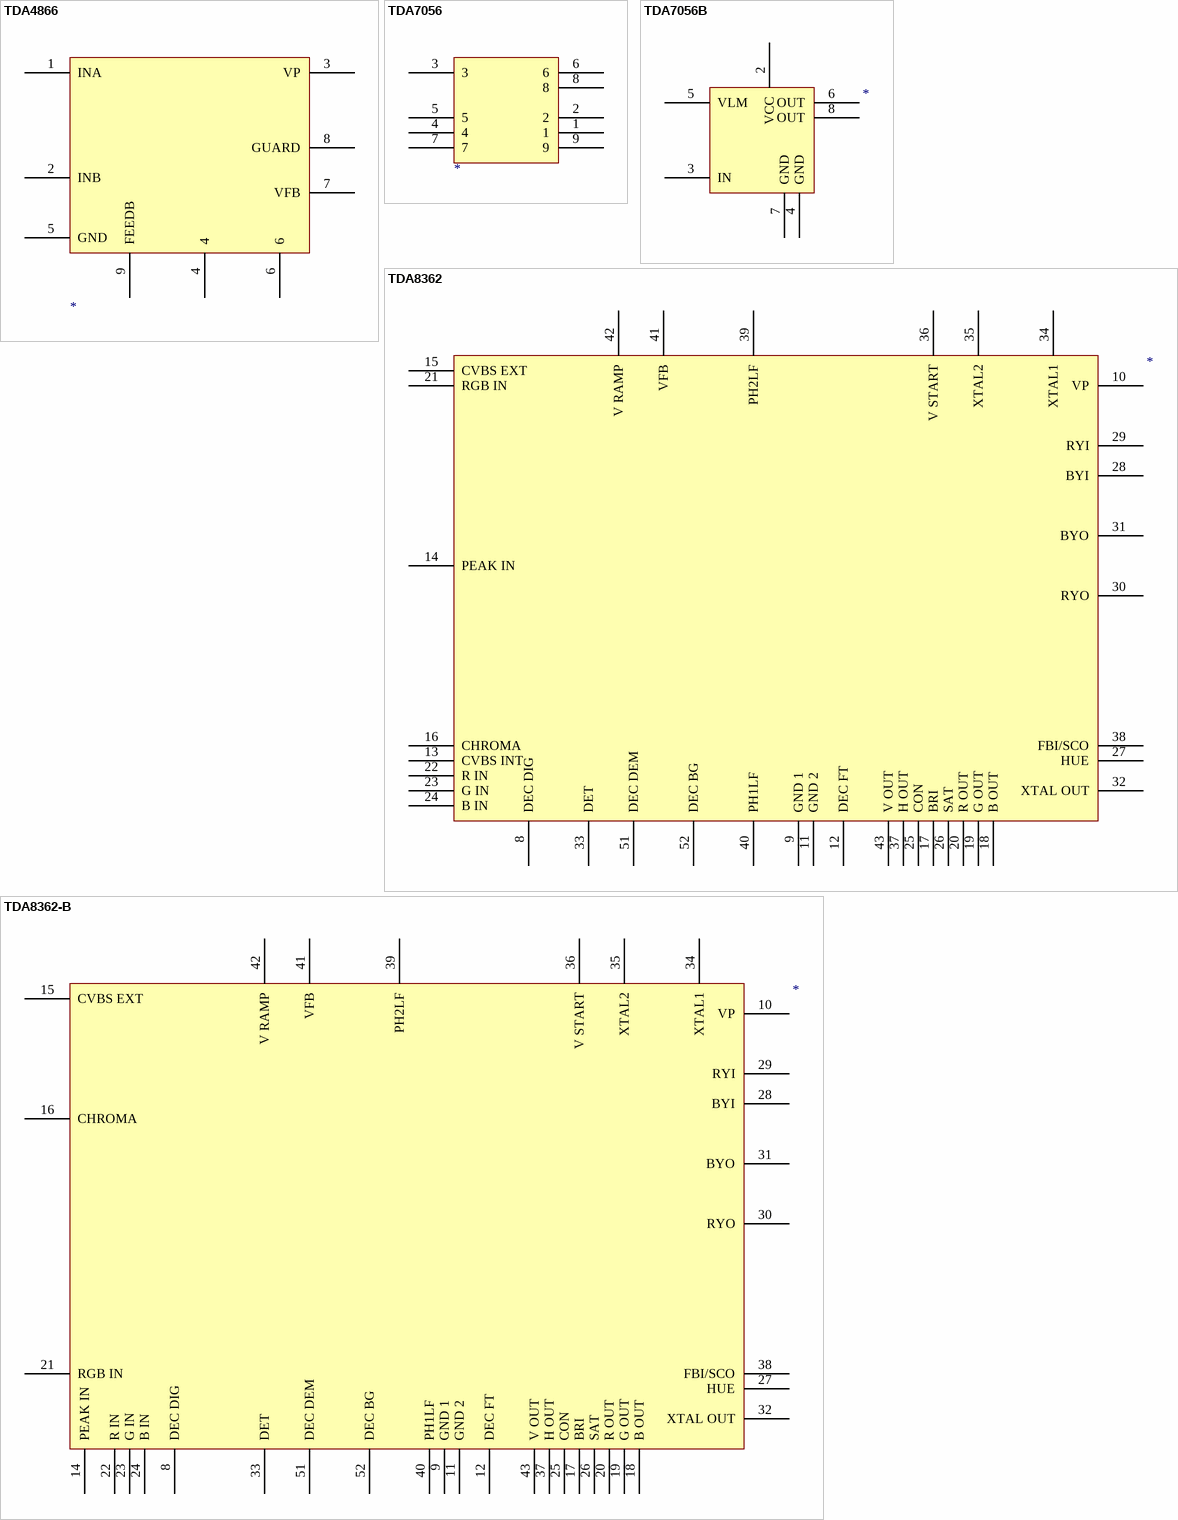
[diagram p64: symbols TDA4866 to TDA8362-B]

## TDA4866
designator ?
U?
pins: 1 INA, 2 INB, 3 VP, 4, 5 GND, 6, 7 VFB, 8 GUARD, 9 FEEDB

## TDA7056
designator ?
pins: 1, 2, 3, 4, 5, 6, 7, 8, 9

## TDA7056B
designator ?
pins: 2 VCC, 3 IN, 4 GND, 5 VLM, 6 OUT, 7 GND, 8 OUT

## TDA8362
designator ?
U?
footprint DIP52
pins: 8 DEC DIG, 9 GND 1, 10 VP, 11 GND 2, 12 DEC FT, 13 CVBS INT, 14 PEAK IN, 15 CVBS EXT, 16 CHROMA, 17 BRI, 18 B OUT, 19 G OUT, 20 R OUT, 21 RGB IN, 22 R IN, 23 G IN, 24 B IN, 25 CON, 26 SAT, 27 HUE, 28 BYI, 29 RYI, 30 RYO, 31 BYO, 32 XTAL OUT, 33 DET, 34 XTAL1, 35 XTAL2, 36 V START, 37 H OUT, 38 FBI/SCO, 39 PH2LF, 40 PH1LF, 41 VFB, 42 V RAMP, 43 V OUT, 51 DEC DEM, 52 DEC BG

## TDA8362-B
designator ?
pins: 8 DEC DIG, 9 GND 1, 10 VP, 11 GND 2, 12 DEC FT, 14 PEAK IN, 15 CVBS EXT, 16 CHROMA, 17 BRI, 18 B OUT, 19 G OUT, 20 R OUT, 21 RGB IN, 22 R IN, 23 G IN, 24 B IN, 25 CON, 26 SAT, 27 HUE, 28 BYI, 29 RYI, 30 RYO, 31 BYO, 32 XTAL OUT, 33 DET, 34 XTAL1, 35 XTAL2, 36 V START, 37 H OUT, 38 FBI/SCO, 39 PH2LF, 40 PH1LF, 41 VFB, 42 V RAMP, 43 V OUT, 51 DEC DEM, 52 DEC BG

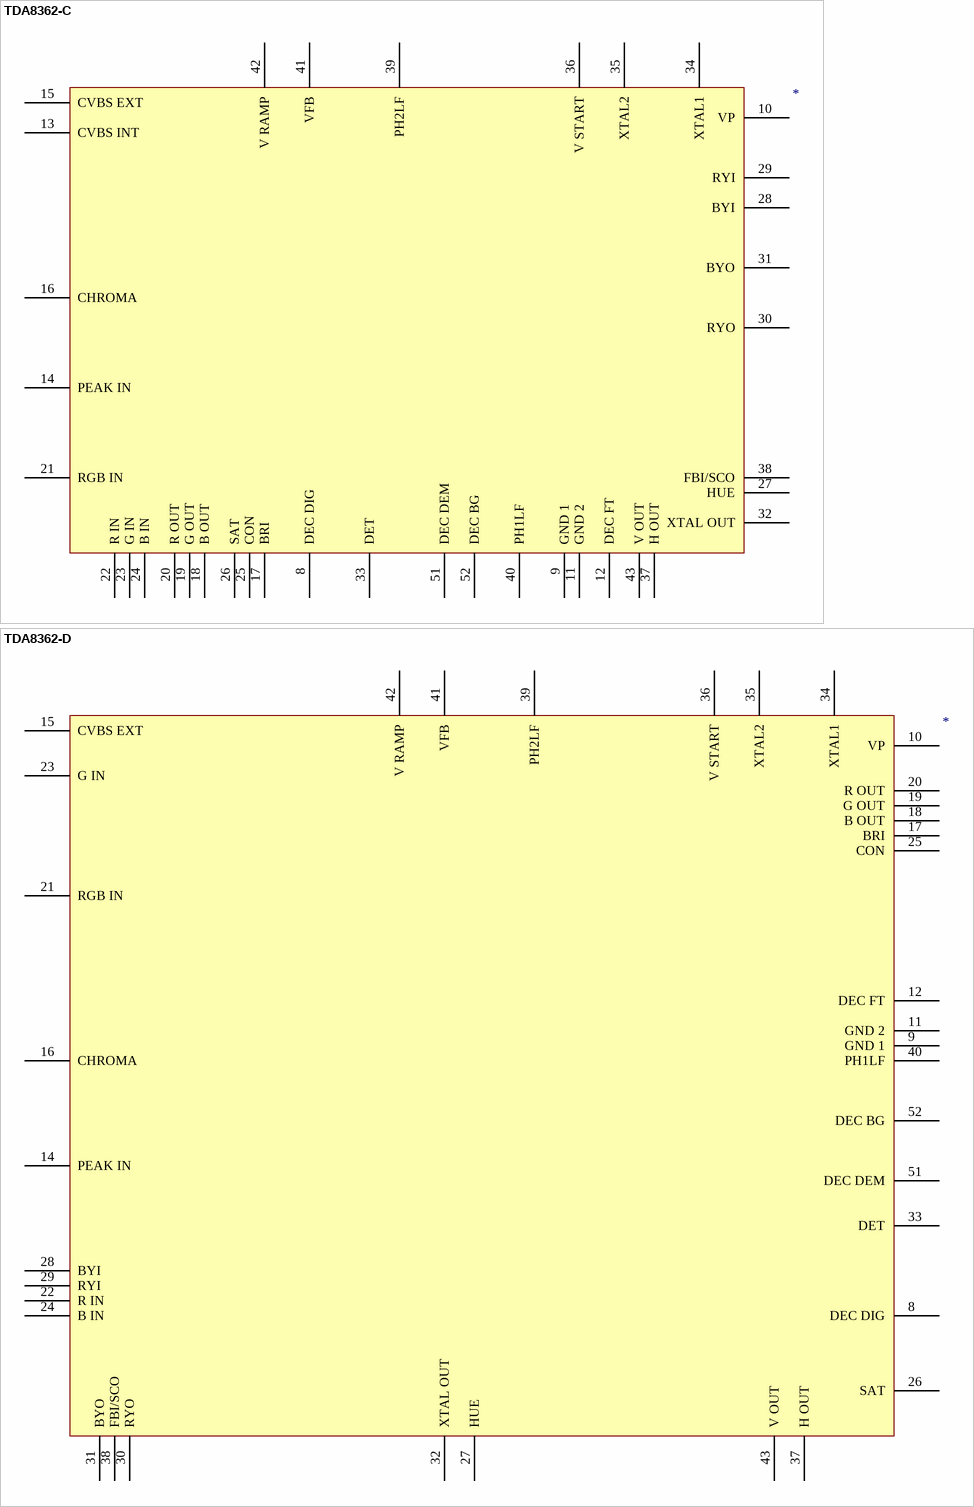
[diagram p65: symbols TDA8362-C to TDA8362-D]

## TDA8362-C
designator ?
pins: 8 DEC DIG, 9 GND 1, 10 VP, 11 GND 2, 12 DEC FT, 13 CVBS INT, 14 PEAK IN, 15 CVBS EXT, 16 CHROMA, 17 BRI, 18 B OUT, 19 G OUT, 20 R OUT, 21 RGB IN, 22 R IN, 23 G IN, 24 B IN, 25 CON, 26 SAT, 27 HUE, 28 BYI, 29 RYI, 30 RYO, 31 BYO, 32 XTAL OUT, 33 DET, 34 XTAL1, 35 XTAL2, 36 V START, 37 H OUT, 38 FBI/SCO, 39 PH2LF, 40 PH1LF, 41 VFB, 42 V RAMP, 43 V OUT, 51 DEC DEM, 52 DEC BG

## TDA8362-D
designator ?
pins: 8 DEC DIG, 9 GND 1, 10 VP, 11 GND 2, 12 DEC FT, 14 PEAK IN, 15 CVBS EXT, 16 CHROMA, 17 BRI, 18 B OUT, 19 G OUT, 20 R OUT, 21 RGB IN, 22 R IN, 23 G IN, 24 B IN, 25 CON, 26 SAT, 27 HUE, 28 BYI, 29 RYI, 30 RYO, 31 BYO, 32 XTAL OUT, 33 DET, 34 XTAL1, 35 XTAL2, 36 V START, 37 H OUT, 38 FBI/SCO, 39 PH2LF, 40 PH1LF, 41 VFB, 42 V RAMP, 43 V OUT, 51 DEC DEM, 52 DEC BG

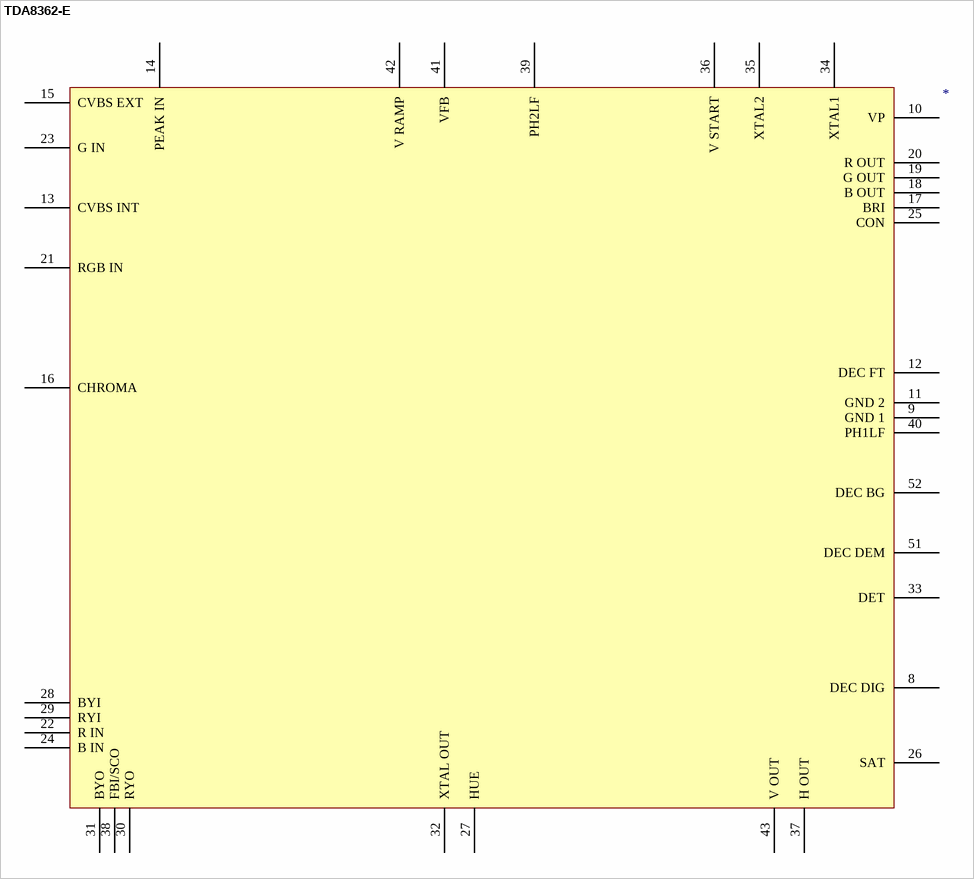
[diagram p66: symbol TDA8362-E]

## TDA8362-E
designator ?
pins: 8 DEC DIG, 9 GND 1, 10 VP, 11 GND 2, 12 DEC FT, 13 CVBS INT, 14 PEAK IN, 15 CVBS EXT, 16 CHROMA, 17 BRI, 18 B OUT, 19 G OUT, 20 R OUT, 21 RGB IN, 22 R IN, 23 G IN, 24 B IN, 25 CON, 26 SAT, 27 HUE, 28 BYI, 29 RYI, 30 RYO, 31 BYO, 32 XTAL OUT, 33 DET, 34 XTAL1, 35 XTAL2, 36 V START, 37 H OUT, 38 FBI/SCO, 39 PH2LF, 40 PH1LF, 41 VFB, 42 V RAMP, 43 V OUT, 51 DEC DEM, 52 DEC BG

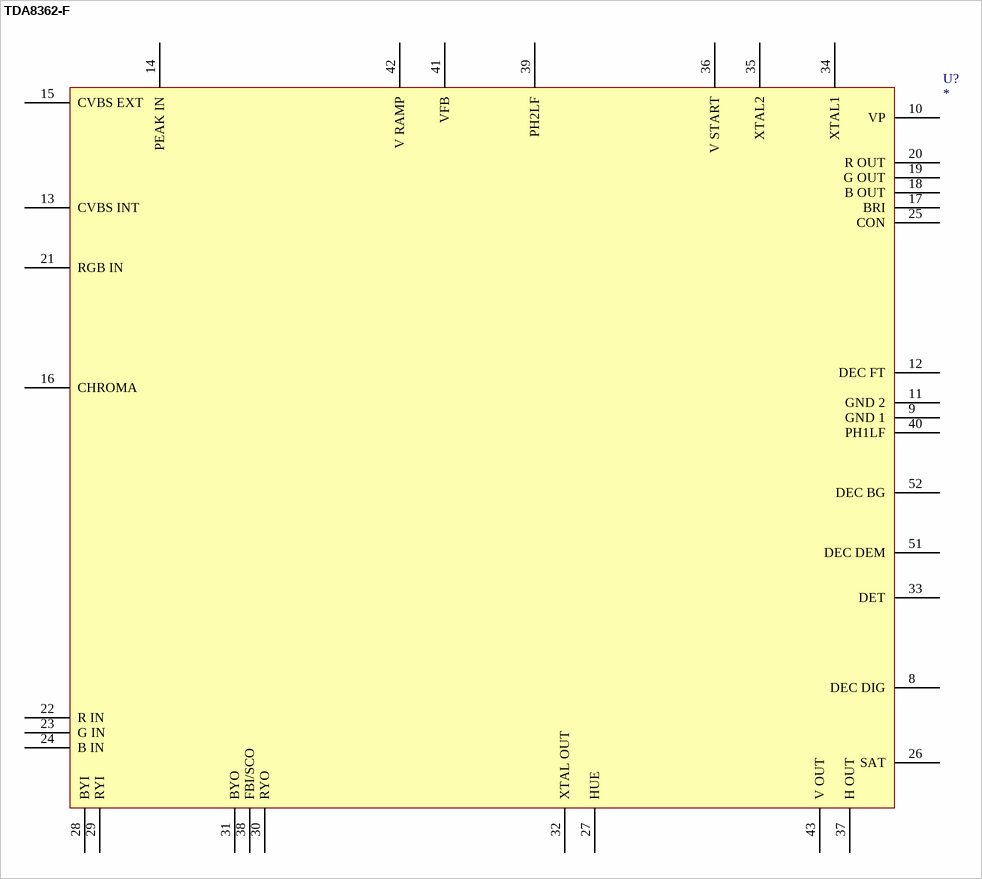
[diagram p67: symbol TDA8362-F]

## TDA8362-F
designator U?
footprint DIL52
pins: 8 DEC DIG, 9 GND 1, 10 VP, 11 GND 2, 12 DEC FT, 13 CVBS INT, 14 PEAK IN, 15 CVBS EXT, 16 CHROMA, 17 BRI, 18 B OUT, 19 G OUT, 20 R OUT, 21 RGB IN, 22 R IN, 23 G IN, 24 B IN, 25 CON, 26 SAT, 27 HUE, 28 BYI, 29 RYI, 30 RYO, 31 BYO, 32 XTAL OUT, 33 DET, 34 XTAL1, 35 XTAL2, 36 V START, 37 H OUT, 38 FBI/SCO, 39 PH2LF, 40 PH1LF, 41 VFB, 42 V RAMP, 43 V OUT, 51 DEC DEM, 52 DEC BG

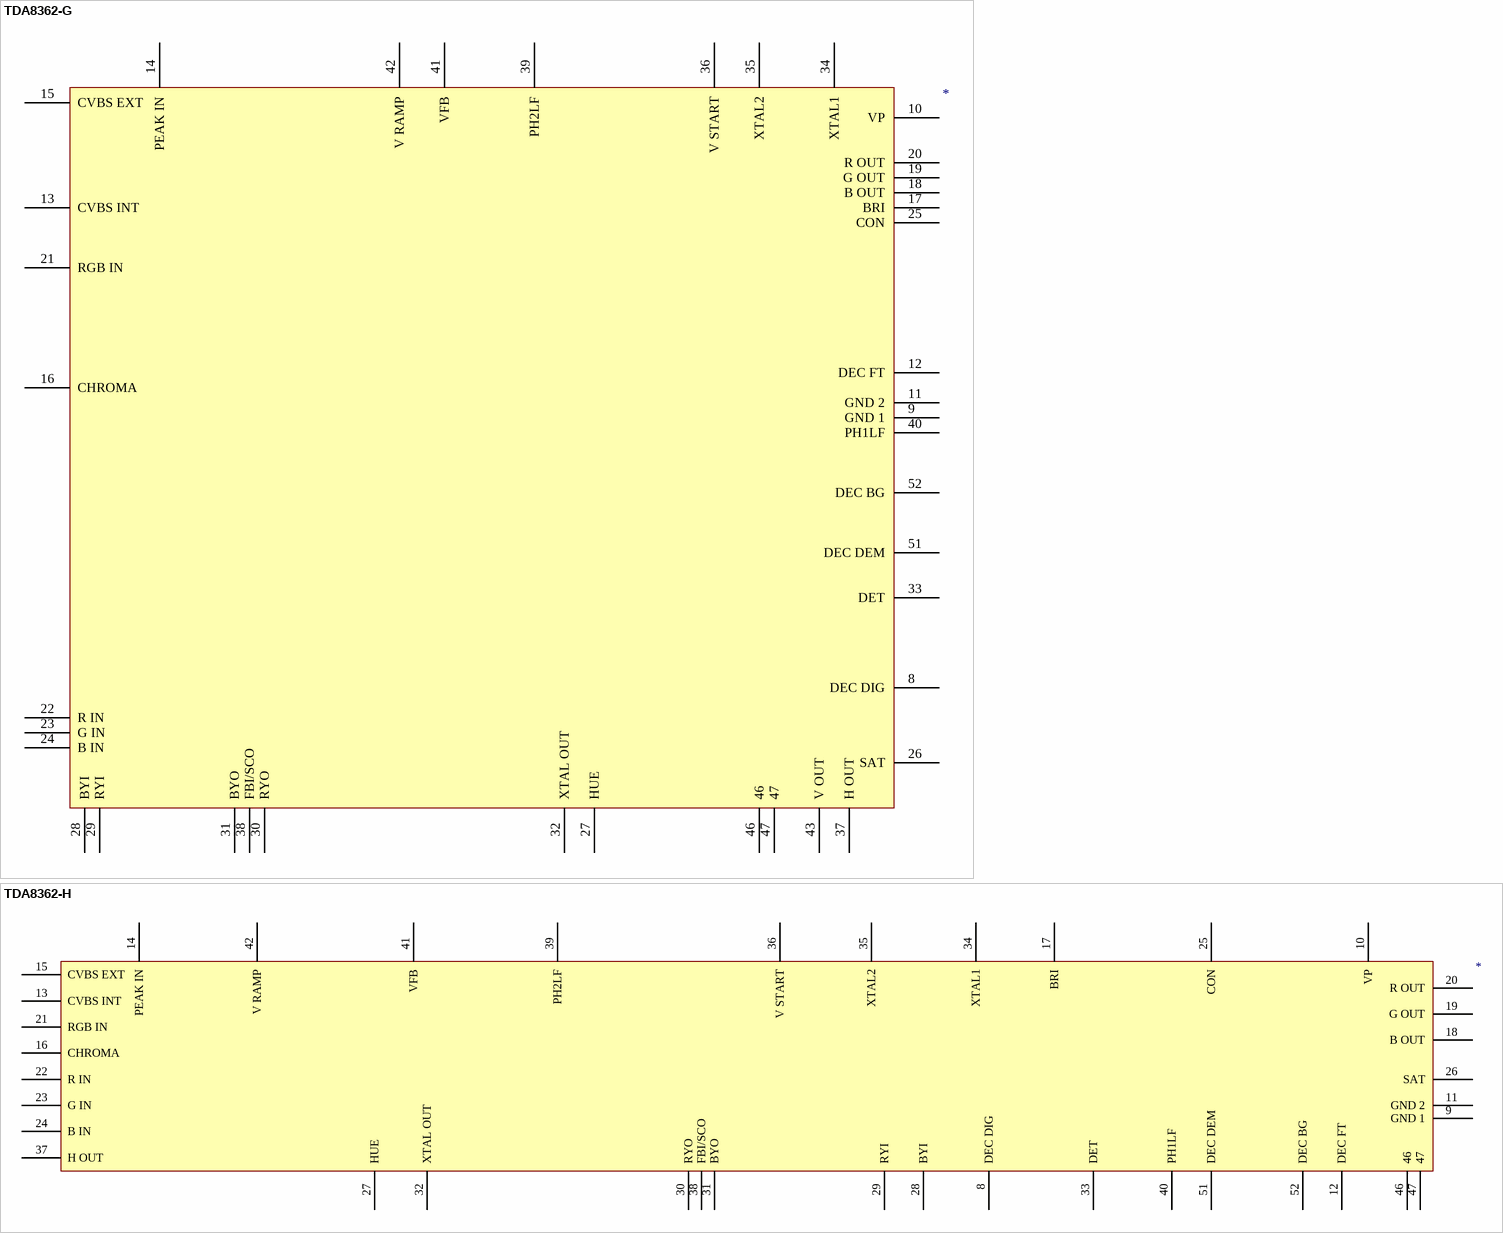
[diagram p68: symbols TDA8362-G to TDA8362-H]

## TDA8362-G
designator ?
pins: 8 DEC DIG, 9 GND 1, 10 VP, 11 GND 2, 12 DEC FT, 13 CVBS INT, 14 PEAK IN, 15 CVBS EXT, 16 CHROMA, 17 BRI, 18 B OUT, 19 G OUT, 20 R OUT, 21 RGB IN, 22 R IN, 23 G IN, 24 B IN, 25 CON, 26 SAT, 27 HUE, 28 BYI, 29 RYI, 30 RYO, 31 BYO, 32 XTAL OUT, 33 DET, 34 XTAL1, 35 XTAL2, 36 V START, 37 H OUT, 38 FBI/SCO, 39 PH2LF, 40 PH1LF, 41 VFB, 42 V RAMP, 43 V OUT, 46, 47, 51 DEC DEM, 52 DEC BG

## TDA8362-H
designator ?
pins: 8 DEC DIG, 9 GND 1, 10 VP, 11 GND 2, 12 DEC FT, 13 CVBS INT, 14 PEAK IN, 15 CVBS EXT, 16 CHROMA, 17 BRI, 18 B OUT, 19 G OUT, 20 R OUT, 21 RGB IN, 22 R IN, 23 G IN, 24 B IN, 25 CON, 26 SAT, 27 HUE, 28 BYI, 29 RYI, 30 RYO, 31 BYO, 32 XTAL OUT, 33 DET, 34 XTAL1, 35 XTAL2, 36 V START, 37 H OUT, 38 FBI/SCO, 39 PH2LF, 40 PH1LF, 41 VFB, 42 V RAMP, 46, 47, 51 DEC DEM, 52 DEC BG

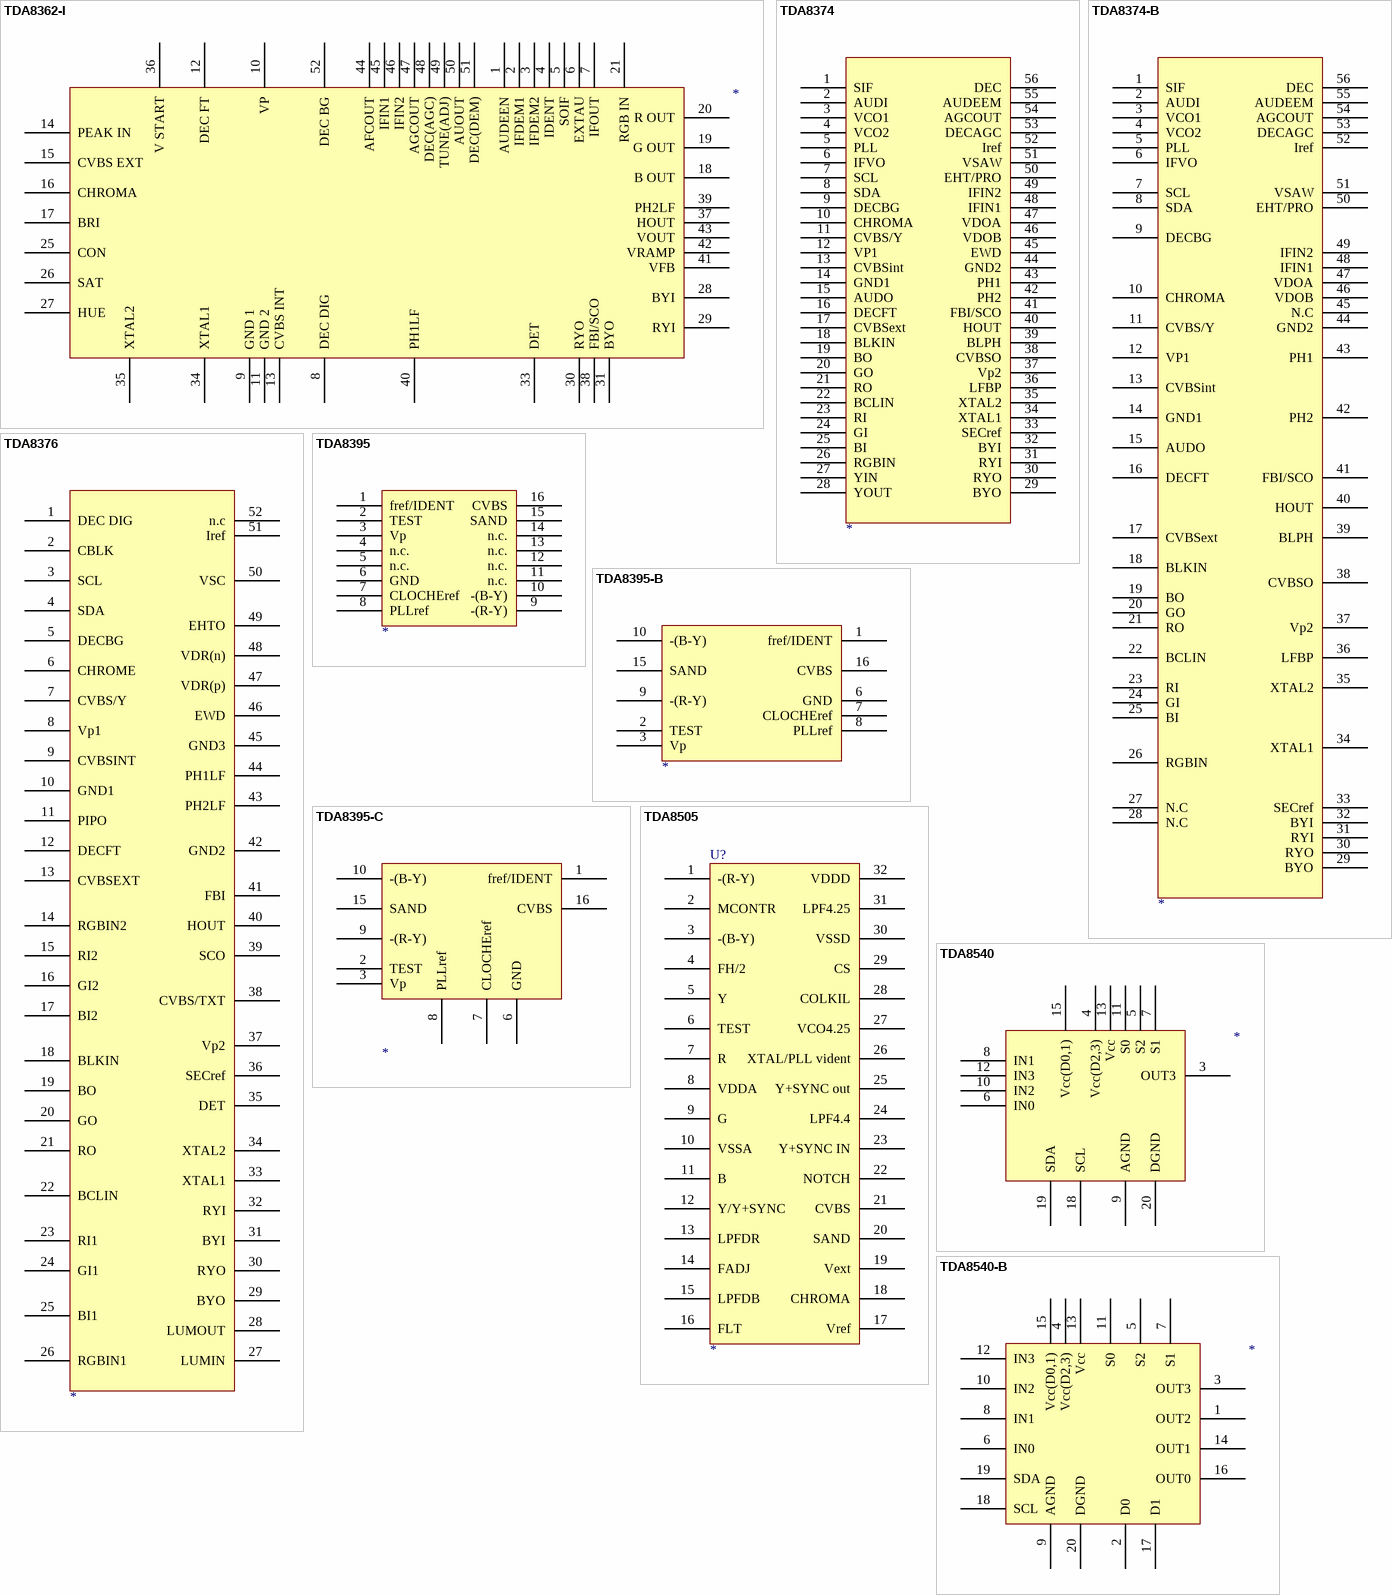
[diagram p69: symbols TDA8362-I to TDA8540-B]

## TDA8362-I
designator ?
pins: 1 AUDEEN, 2 IFDEM1, 3 IFDEM2, 4 IDENT, 5 SOIF, 6 EXTAU, 7 IFOUT, 8 DEC DIG, 9 GND 1, 10 VP, 11 GND 2, 12 DEC FT, 13 CVBS INT, 14 PEAK IN, 15 CVBS EXT, 16 CHROMA, 17 BRI, 18 B OUT, 19 G OUT, 20 R OUT, 21 RGB IN, 25 CON, 26 SAT, 27 HUE, 28 BYI, 29 RYI, 30 RYO, 31 BYO, 33 DET, 34 XTAL1, 35 XTAL2, 36 V START, 37 HOUT, 38 FBI/SCO, 39 PH2LF, 40 PH1LF, 41 VFB, 42 VRAMP, 43 VOUT, 44 AFCOUT, 45 IFIN1, 46 IFIN2, 47 AGCOUT, 48 DEC(AGC), 49 TUNE(ADJ), 50 AUOUT, 51 DEC(DEM), 52 DEC BG

## TDA8374
designator ?
U?
footprint DIP56
pins: 1 SIF, 2 AUDI, 3 VCO1, 4 VCO2, 5 PLL, 6 IFVO, 7 SCL, 8 SDA, 9 DECBG, 10 CHROMA, 11 CVBS/Y, 12 VP1, 13 CVBSint, 14 GND1, 15 AUDO, 16 DECFT, 17 CVBSext, 18 BLKIN, 19 BO, 20 GO, 21 RO, 22 BCLIN, 23 RI, 24 GI, 25 BI, 26 RGBIN, 27 YIN, 28 YOUT, 29 BYO, 30 RYO, 31 RYI, 32 BYI, 33 SECref, 34 XTAL1, 35 XTAL2, 36 LFBP, 37 Vp2, 38 CVBSO, 39 BLPH, 40 HOUT, 41 FBI/SCO, 42 PH2, 43 PH1, 44 GND2, 45 EWD, 46 VDOB, 47 VDOA, 48 IFIN1, 49 IFIN2, 50 EHT/PRO, 51 VSAW, 52 Iref, 53 DECAGC, 54 AGCOUT, 55 AUDEEM, 56 DEC

## TDA8374-B
designator ?
pins: 1 SIF, 2 AUDI, 3 VCO1, 4 VCO2, 5 PLL, 6 IFVO, 7 SCL, 8 SDA, 9 DECBG, 10 CHROMA, 11 CVBS/Y, 12 VP1, 13 CVBSint, 14 GND1, 15 AUDO, 16 DECFT, 17 CVBSext, 18 BLKIN, 19 BO, 20 GO, 21 RO, 22 BCLIN, 23 RI, 24 GI, 25 BI, 26 RGBIN, 27 N.C, 28 N.C, 29 BYO, 30 RYO, 31 RYI, 32 BYI, 33 SECref, 34 XTAL1, 35 XTAL2, 36 LFBP, 37 Vp2, 38 CVBSO, 39 BLPH, 40 HOUT, 41 FBI/SCO, 42 PH2, 43 PH1, 44 GND2, 45 N.C, 46 VDOB, 47 VDOA, 48 IFIN1, 49 IFIN2, 50 EHT/PRO, 51 VSAW, 52 Iref, 53 DECAGC, 54 AGCOUT, 55 AUDEEM, 56 DEC

## TDA8376
designator ?
pins: 1 DEC DIG, 2 CBLK, 3 SCL, 4 SDA, 5 DECBG, 6 CHROME, 7 CVBS/Y, 8 Vp1, 9 CVBSINT, 10 GND1, 11 PIPO, 12 DECFT, 13 CVBSEXT, 14 RGBIN2, 15 RI2, 16 GI2, 17 BI2, 18 BLKIN, 19 BO, 20 GO, 21 RO, 22 BCLIN, 23 RI1, 24 GI1, 25 BI1, 26 RGBIN1, 27 LUMIN, 28 LUMOUT, 29 BYO, 30 RYO, 31 BYI, 32 RYI, 33 XTAL1, 34 XTAL2, 35 DET, 36 SECref, 37 Vp2, 38 CVBS/TXT, 39 SCO, 40 HOUT, 41 FBI, 42 GND2, 43 PH2LF, 44 PH1LF, 45 GND3, 46 EWD, 47 VDR(p), 48 VDR(n), 49 EHTO, 50 VSC, 51 Iref, 52 n.c

## TDA8395
designator ?
U?
footprint DIP16
pins: 1 fref/IDENT, 2 TEST, 3 Vp, 4 n.c., 5 n.c., 6 GND, 7 CLOCHEref, 8 PLLref, 9 -(R-Y), 10 -(B-Y), 11 n.c., 12 n.c., 13 n.c., 14 n.c., 15 SAND, 16 CVBS

## TDA8395-B
designator ?
pins: 1 fref/IDENT, 2 TEST, 3 Vp, 6 GND, 7 CLOCHEref, 8 PLLref, 9 -(R-Y), 10 -(B-Y), 15 SAND, 16 CVBS

## TDA8395-C
designator ?
pins: 1 fref/IDENT, 2 TEST, 3 Vp, 6 GND, 7 CLOCHEref, 8 PLLref, 9 -(R-Y), 10 -(B-Y), 15 SAND, 16 CVBS

## TDA8505
designator U?
footprint DIL32
pins: 1 -(R-Y), 2 MCONTR, 3 -(B-Y), 4 FH/2, 5 Y, 6 TEST, 7 R, 8 VDDA, 9 G, 10 VSSA, 11 B, 12 Y/Y+SYNC, 13 LPFDR, 14 FADJ, 15 LPFDB, 16 FLT, 17 Vref, 18 CHROMA, 19 Vext, 20 SAND, 21 CVBS, 22 NOTCH, 23 Y+SYNC IN, 24 LPF4.4, 25 Y+SYNC out, 26 XTAL/PLL vident, 27 VCO4.25, 28 COLKIL, 29 CS, 30 VSSD, 31 LPF4.25, 32 VDDD

## TDA8540
designator ?
pins: 3 OUT3, 4 Vcc(D2,3), 5 S2, 6 IN0, 7 S1, 8 IN1, 9 AGND, 10 IN2, 11 S0, 12 IN3, 13 Vcc, 15 Vcc(D0,1), 18 SCL, 19 SDA, 20 DGND

## TDA8540-B
designator ?
pins: 1 OUT2, 2 D0, 3 OUT3, 4 Vcc(D2,3), 5 S2, 6 IN0, 7 S1, 8 IN1, 9 AGND, 10 IN2, 11 S0, 12 IN3, 13 Vcc, 14 OUT1, 15 Vcc(D0,1), 16 OUT0, 17 D1, 18 SCL, 19 SDA, 20 DGND

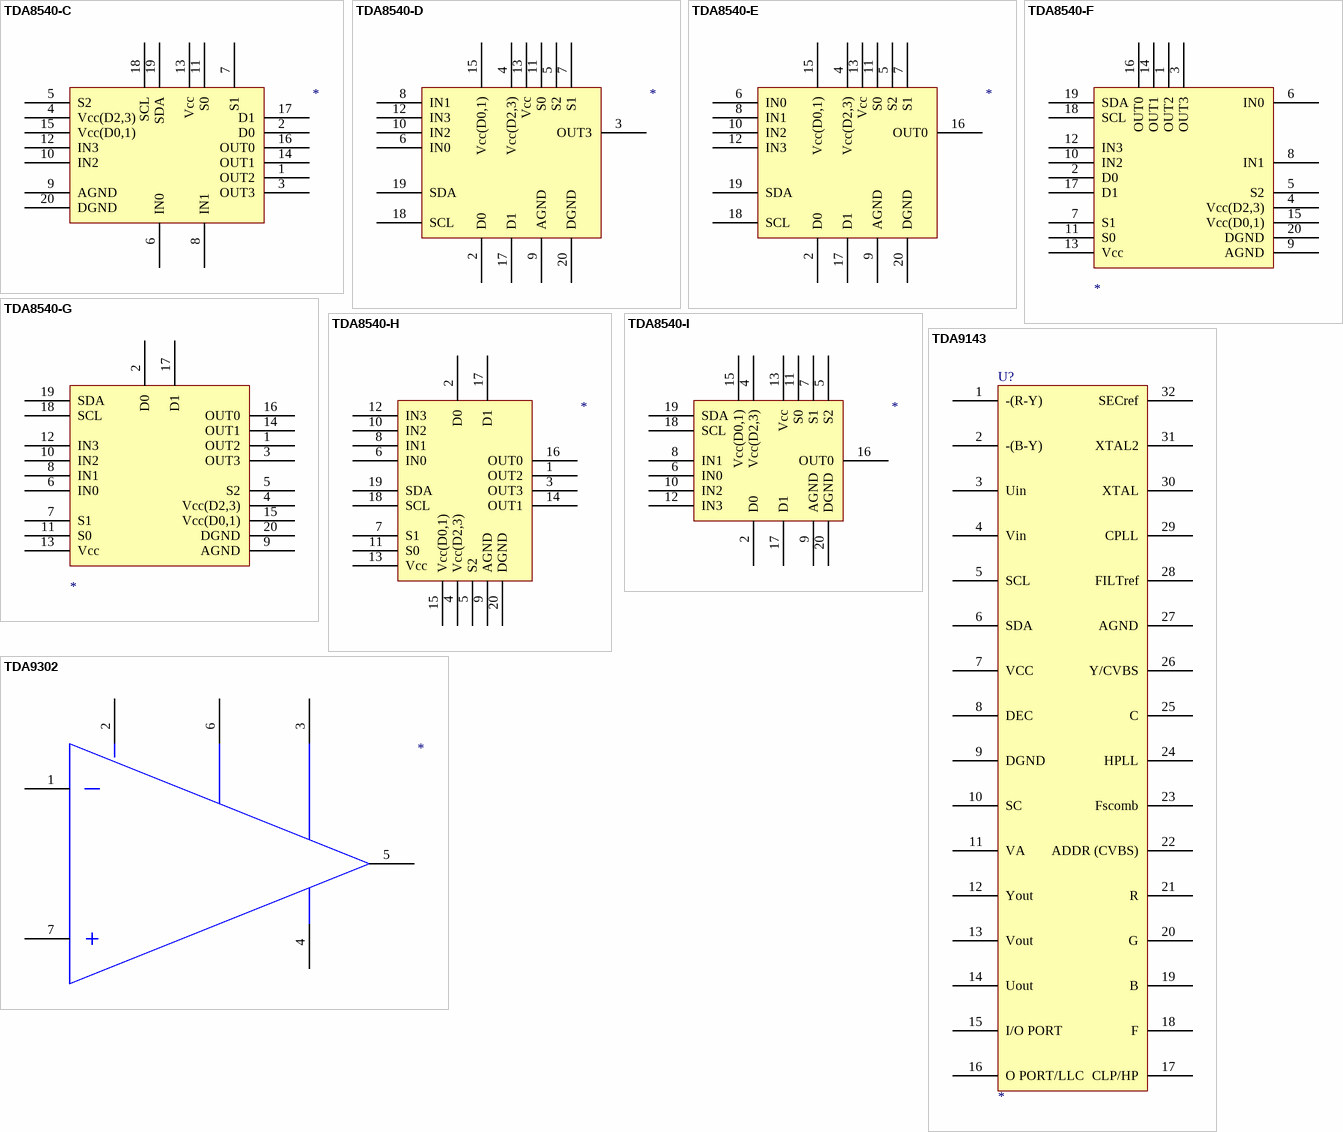
[diagram p70: symbols TDA8540-C to TDA9302]

## TDA8540-C
designator ?
pins: 1 OUT2, 2 D0, 3 OUT3, 4 Vcc(D2,3), 5 S2, 6 IN0, 7 S1, 8 IN1, 9 AGND, 10 IN2, 11 S0, 12 IN3, 13 Vcc, 14 OUT1, 15 Vcc(D0,1), 16 OUT0, 17 D1, 18 SCL, 19 SDA, 20 DGND

## TDA8540-D
designator ?
pins: 2 D0, 3 OUT3, 4 Vcc(D2,3), 5 S2, 6 IN0, 7 S1, 8 IN1, 9 AGND, 10 IN2, 11 S0, 12 IN3, 13 Vcc, 15 Vcc(D0,1), 17 D1, 18 SCL, 19 SDA, 20 DGND

## TDA8540-E
designator ?
pins: 2 D0, 4 Vcc(D2,3), 5 S2, 6 IN0, 7 S1, 8 IN1, 9 AGND, 10 IN2, 11 S0, 12 IN3, 13 Vcc, 15 Vcc(D0,1), 16 OUT0, 17 D1, 18 SCL, 19 SDA, 20 DGND

## TDA8540-F
designator ?
pins: 1 OUT2, 2 D0, 3 OUT3, 4 Vcc(D2,3), 5 S2, 6 IN0, 7 S1, 8 IN1, 9 AGND, 10 IN2, 11 S0, 12 IN3, 13 Vcc, 14 OUT1, 15 Vcc(D0,1), 16 OUT0, 17 D1, 18 SCL, 19 SDA, 20 DGND

## TDA8540-G
designator ?
pins: 1 OUT2, 2 D0, 3 OUT3, 4 Vcc(D2,3), 5 S2, 6 IN0, 7 S1, 8 IN1, 9 AGND, 10 IN2, 11 S0, 12 IN3, 13 Vcc, 14 OUT1, 15 Vcc(D0,1), 16 OUT0, 17 D1, 18 SCL, 19 SDA, 20 DGND

## TDA8540-H
designator ?
pins: 1 OUT2, 2 D0, 3 OUT3, 4 Vcc(D2,3), 5 S2, 6 IN0, 7 S1, 8 IN1, 9 AGND, 10 IN2, 11 S0, 12 IN3, 13 Vcc, 14 OUT1, 15 Vcc(D0,1), 16 OUT0, 17 D1, 18 SCL, 19 SDA, 20 DGND

## TDA8540-I
designator ?
pins: 2 D0, 4 Vcc(D2,3), 5 S2, 6 IN0, 7 S1, 8 IN1, 9 AGND, 10 IN2, 11 S0, 12 IN3, 13 Vcc, 15 Vcc(D0,1), 16 OUT0, 17 D1, 18 SCL, 19 SDA, 20 DGND

## TDA9143
designator U?
footprint DIL32
pins: 1 -(R-Y), 2 -(B-Y), 3 Uin, 4 Vin, 5 SCL, 6 SDA, 7 VCC, 8 DEC, 9 DGND, 10 SC, 11 VA, 12 Yout, 13 Vout, 14 Uout, 15 I/O PORT, 16 O PORT/LLC, 17 CLP/HP, 18 F, 19 B, 20 G, 21 R, 22 ADDR (CVBS), 23 Fscomb, 24 HPLL, 25 C, 26 Y/CVBS, 27 AGND, 28 FILTref, 29 CPLL, 30 XTAL, 31 XTAL2, 32 SECref

## TDA9302
designator ?
pins: 1, 2, 3, 4, 5, 6, 7

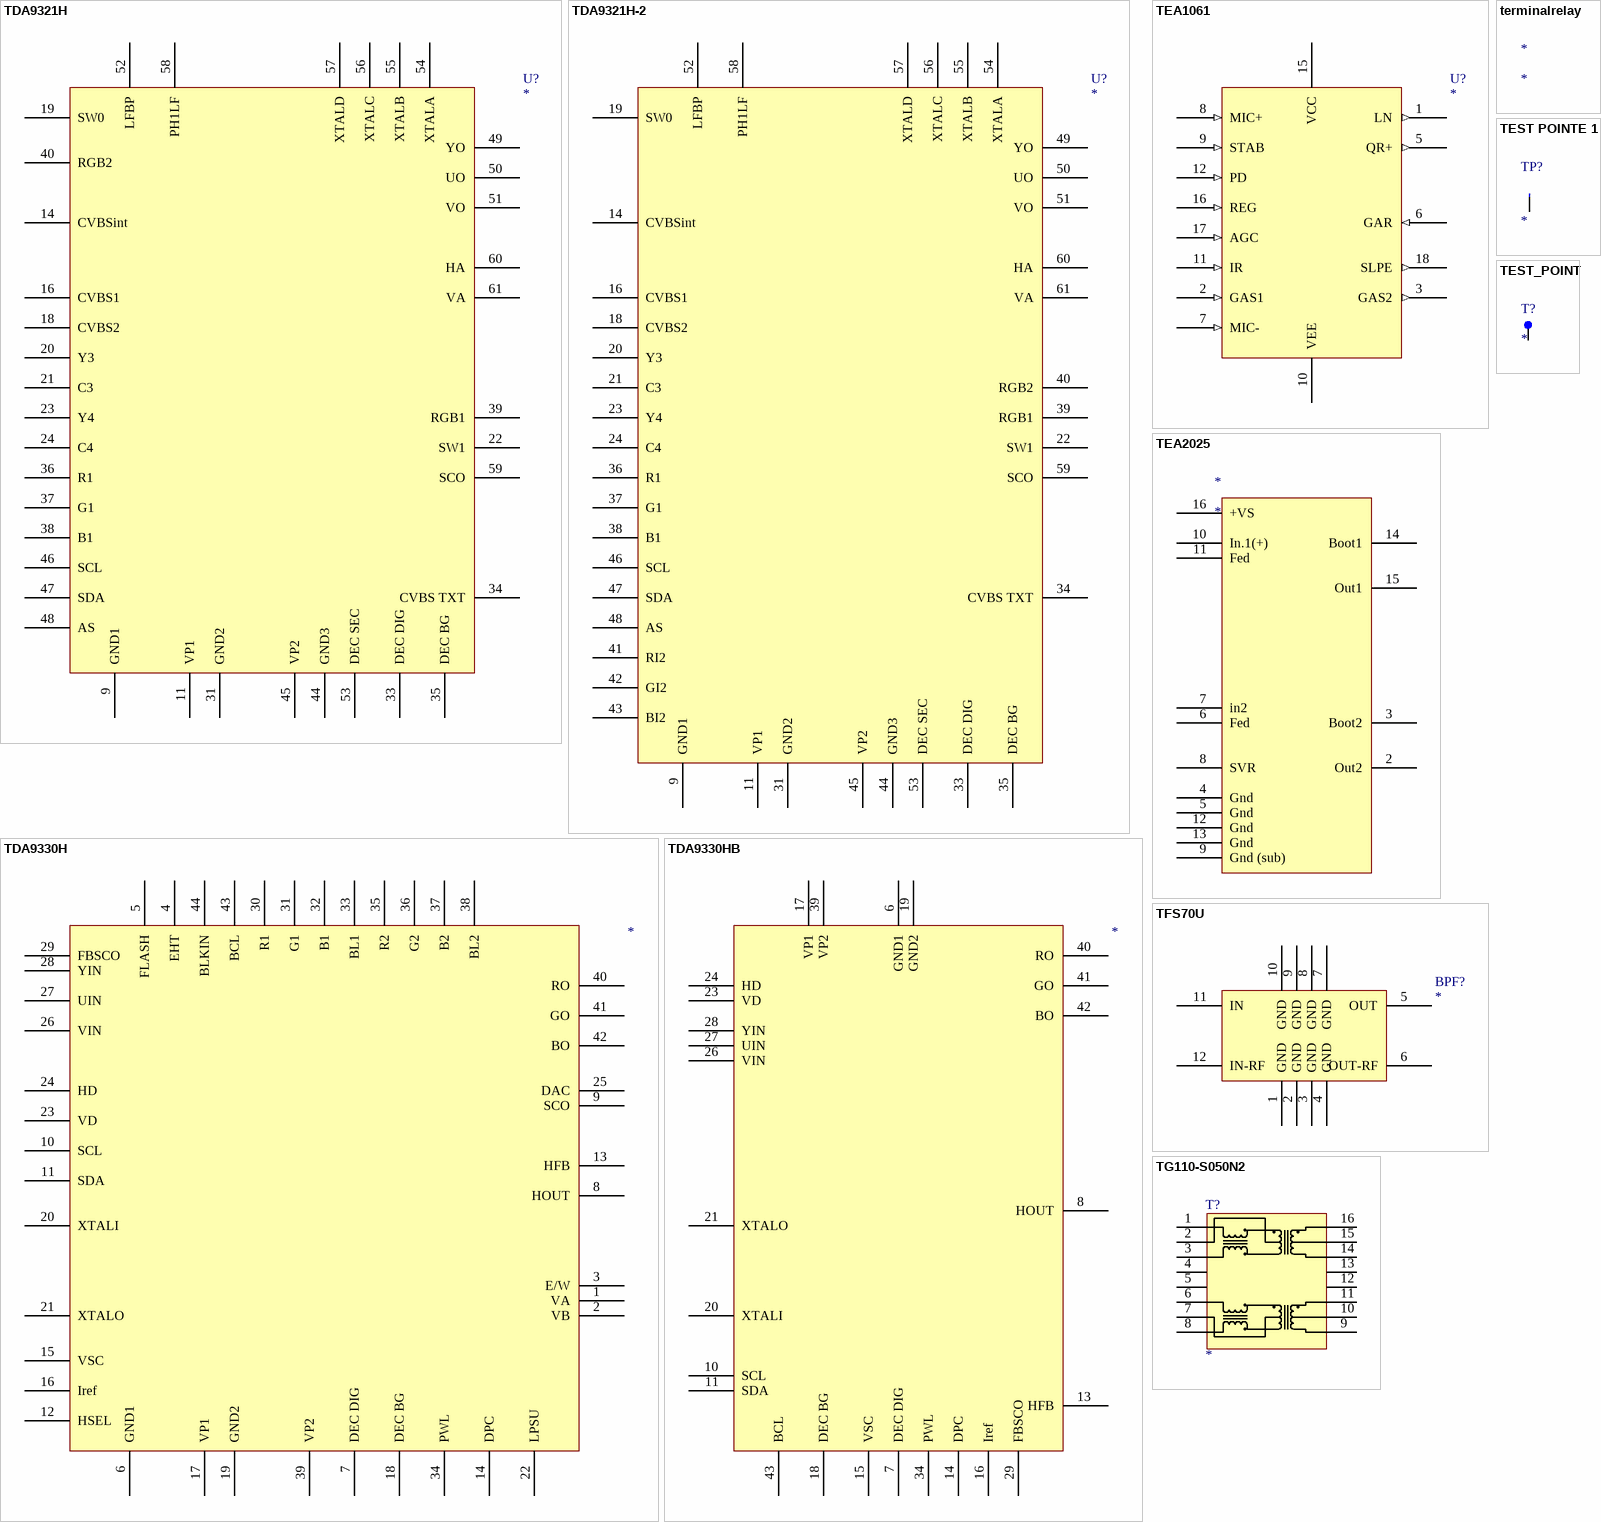
[diagram p71: symbols TDA9321H to TG110-S050N2]

## TDA9321H
designator U?
footprint QFP64-A
pins: 9 GND1, 11 VP1, 14 CVBSint, 16 CVBS1, 18 CVBS2, 19 SW0, 20 Y3, 21 C3, 22 SW1, 23 Y4, 24 C4, 31 GND2, 33 DEC DIG, 34 CVBS TXT, 35 DEC BG, 36 R1, 37 G1, 38 B1, 39 RGB1, 40 RGB2, 44 GND3, 45 VP2, 46 SCL, 47 SDA, 48 AS, 49 YO, 50 UO, 51 VO, 52 LFBP, 53 DEC SEC, 54 XTALA, 55 XTALB, 56 XTALC, 57 XTALD, 58 PH1LF, 59 SCO, 60 HA, 61 VA

## TDA9321H-2
designator U?
footprint QFP64-A
pins: 9 GND1, 11 VP1, 14 CVBSint, 16 CVBS1, 18 CVBS2, 19 SW0, 20 Y3, 21 C3, 22 SW1, 23 Y4, 24 C4, 31 GND2, 33 DEC DIG, 34 CVBS TXT, 35 DEC BG, 36 R1, 37 G1, 38 B1, 39 RGB1, 40 RGB2, 41 RI2, 42 GI2, 43 BI2, 44 GND3, 45 VP2, 46 SCL, 47 SDA, 48 AS, 49 YO, 50 UO, 51 VO, 52 LFBP, 53 DEC SEC, 54 XTALA, 55 XTALB, 56 XTALC, 57 XTALD, 58 PH1LF, 59 SCO, 60 HA, 61 VA

## TDA9330H
designator ?
U?
footprint QFP44-A
pins: 1 VA, 2 VB, 3 E/W, 4 EHT, 5 FLASH, 6 GND1, 7 DEC DIG, 8 HOUT, 9 SCO, 10 SCL, 11 SDA, 12 HSEL, 13 HFB, 14 DPC, 15 VSC, 16 Iref, 17 VP1, 18 DEC BG, 19 GND2, 20 XTALI, 21 XTALO, 22 LPSU, 23 VD, 24 HD, 25 DAC, 26 VIN, 27 UIN, 28 YIN, 29 FBSCO, 30 R1, 31 G1, 32 B1, 33 BL1, 34 PWL, 35 R2, 36 G2, 37 B2, 38 BL2, 39 VP2, 40 RO, 41 GO, 42 BO, 43 BCL, 44 BLKIN

## TDA9330HB
designator ?
U?
footprint QFP44-A
pins: 6 GND1, 7 DEC DIG, 8 HOUT, 10 SCL, 11 SDA, 13 HFB, 14 DPC, 15 VSC, 16 Iref, 17 VP1, 18 DEC BG, 19 GND2, 20 XTALI, 21 XTALO, 23 VD, 24 HD, 26 VIN, 27 UIN, 28 YIN, 29 FBSCO, 34 PWL, 39 VP2, 40 RO, 41 GO, 42 BO, 43 BCL

## TEA1061
designator U?
pins: 1 LN (out), 2 GAS1 (in), 3 GAS2 (out), 5 QR+ (out), 6 GAR (in), 7 MIC- (in), 8 MIC+ (in), 9 STAB (in), 10 VEE, 11 IR (in), 12 PD (in), 15 VCC, 16 REG (in), 17 AGC (in), 18 SLPE (out)

## TEA2025
designator *
pins: 2 Out2, 3 Boot2, 4 Gnd, 5 Gnd, 6 Fed, 7 in2, 8 SVR, 9 Gnd (sub), 10 In.1(+), 11 Fed, 12 Gnd, 13 Gnd, 14 Boot1, 15 Out1, 16 +VS

## terminalrelay
designator *

## TEST POINTE 1
designator TP?
footprint TEST-POINT3
footprint TP1
pins: 1

## TEST_POINT
designator T?
pins: 1

## TFS70U
designator BPF?
footprint BPF3
pins: 1 GND, 2 GND, 3 GND, 4 GND, 5 OUT, 6 OUT-RF, 7 GND, 8 GND, 9 GND, 10 GND, 11 IN, 12 IN-RF

## TG110-S050N2
designator T?
footprint N2
pins: 1, 2, 3, 4, 5, 6, 7, 8, 9, 10, 11, 12, 13, 14, 15, 16

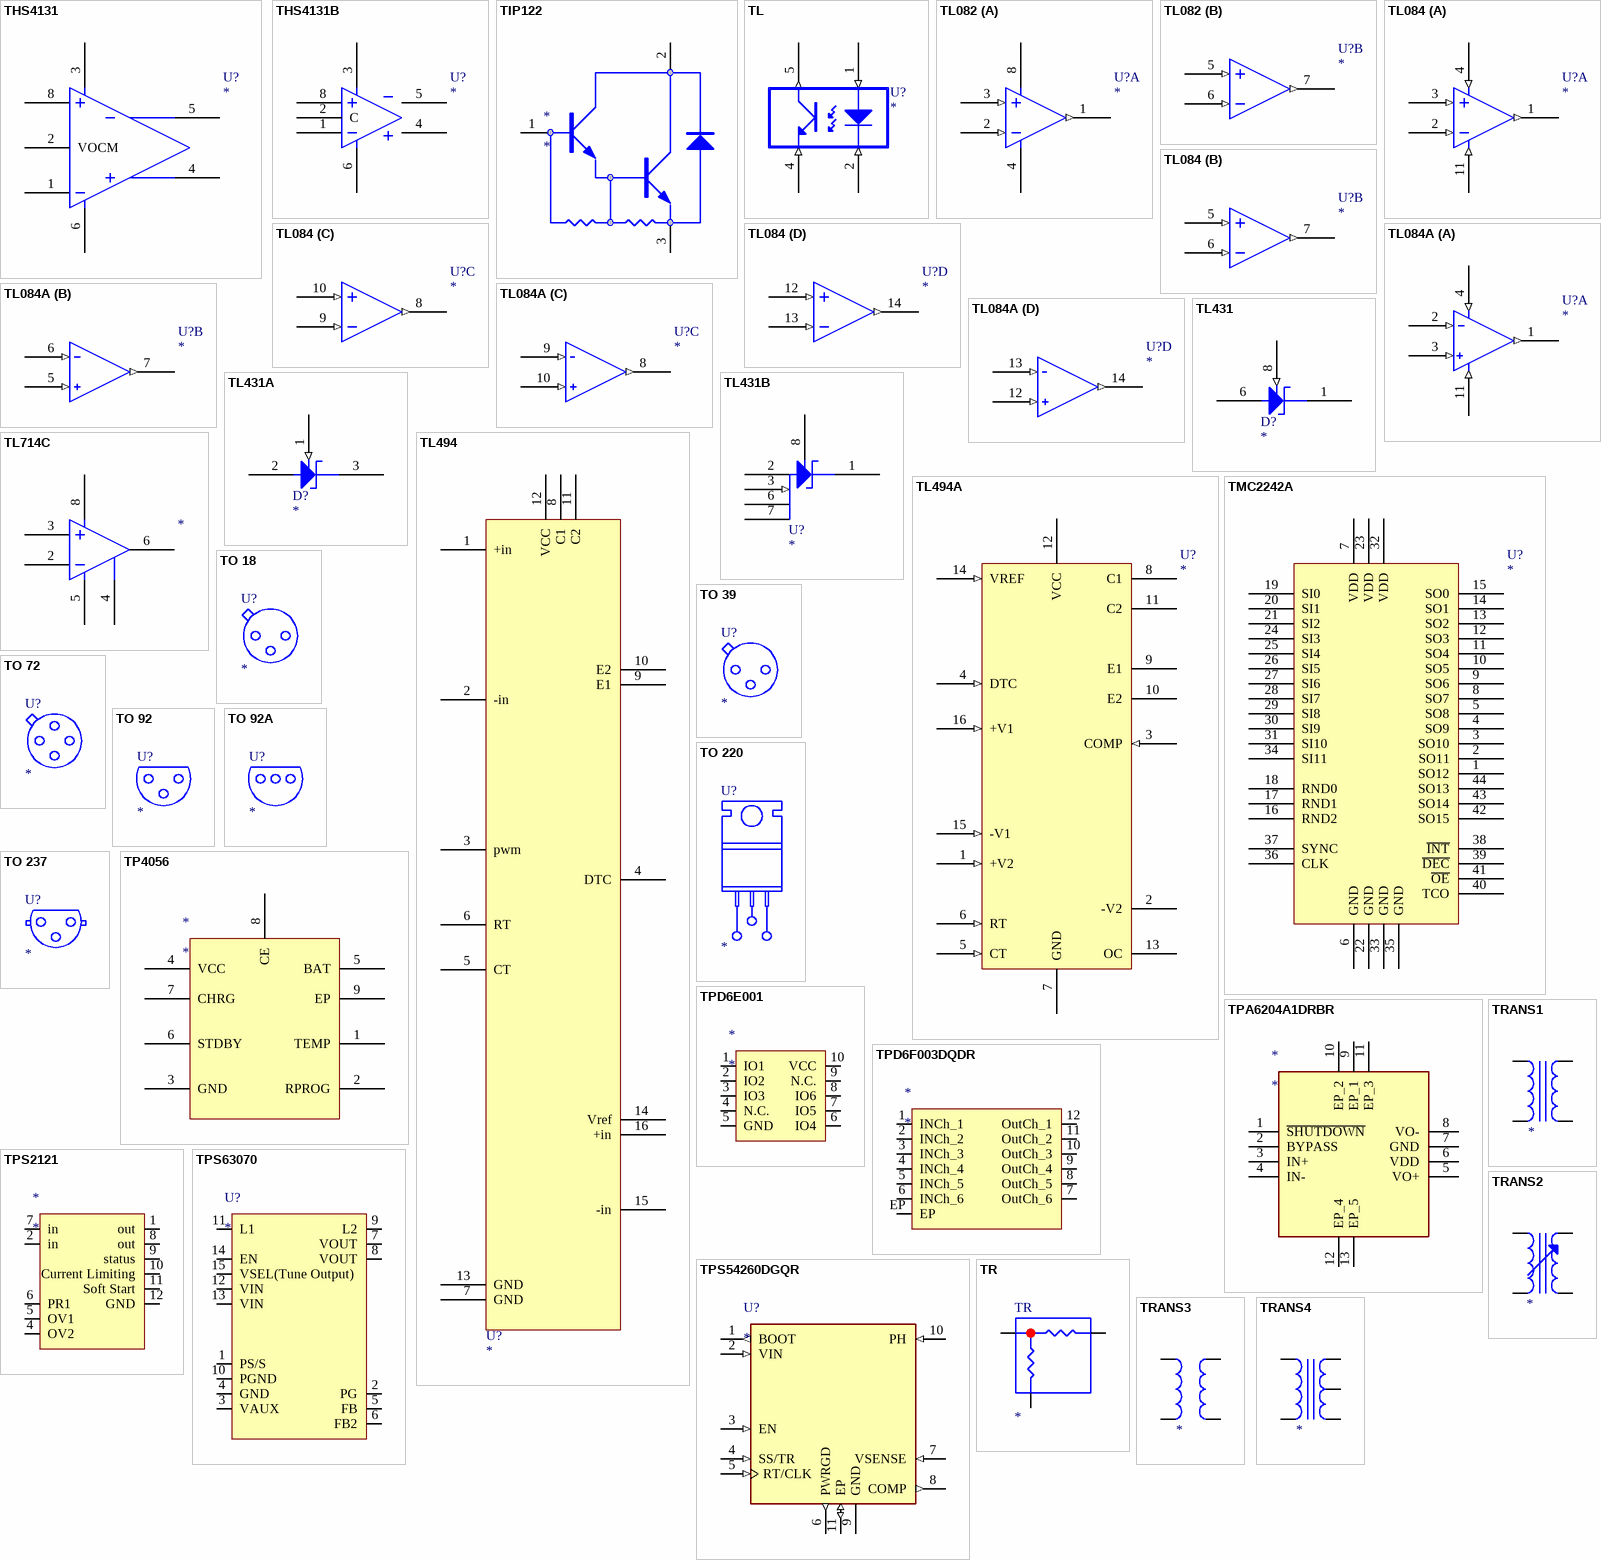
[diagram p72: symbols THS4131 to TRANS4]

## THS4131
designator U?
footprint SO-8
pins: 1, 2 VOCM, 3, 4, 5, 6, 8

## THS4131B
designator U?
footprint SO-8
pins: 1, 2 C, 3, 4, 5, 6, 8

## TIP122
designator *
pins: 1, 2, 3

## TL
designator U?
pins: 1 A (in), 2 C (in), 4 E (in), 5 CL (out)

## TL082
designator U?
part A pins: 1 OUT (out), 2 -IN (in), 3 +IN (in), 4 V-, 8 V+
part B pins: 5 +IN (in), 6 -IN (in), 7 OUT (out)

## TL084
designator U?
part A pins: 1 OUT (out), 2 IN- (in), 3 IN+ (in), 4 V+ (in), 11 V- (in)
part B pins: 5 IN+ (in), 6 IN- (in), 7 OUT (out)
part C pins: 8 OUT (out), 9 IN- (in), 10 IN+ (in)
part D pins: 12 IN+ (in), 13 IN- (in), 14 OUT (out)

## TL084A
designator U?
part A pins: 1 OUT (out), 2 IN- (in), 3 IN+ (in), 4 V+ (in), 11 V- (in)
part B pins: 5 IN+ (in), 6 IN- (in), 7 OUT (out)
part C pins: 8 OUT (out), 9 IN- (in), 10 IN+ (in)
part D pins: 12 IN+ (in), 13 IN- (in), 14 OUT (out)

## TL431
designator D?
pins: 1 C, 6 A, 8 VREF (in)

## TL431A
designator D?
footprint to-92
pins: 1 VREF (in), 2 A, 3 C

## TL431B
designator U?
footprint SO-8
pins: 1 C, 2 A, 3 VREF (in), 6, 7, 8

## TL494
designator U?
footprint DIP16
pins: 1 +in, 2 -in, 3 pwm, 4 DTC, 5 CT, 6 RT, 7 GND, 8 C1, 9 E1, 10 E2, 11 C2, 12 VCC, 13 GND, 14 Vref, 15 -in, 16 +in

## TL494A
designator U?
pins: 1 +V2 (in), 2 -V2, 3 COMP (in), 4 DTC (in), 5 CT (in), 6 RT (in), 7 GND, 8 C1, 9 E1, 10 E2, 11 C2, 12 VCC, 13 OC, 14 VREF (in), 15 -V1 (in), 16 +V1 (in)

## TL714C
designator ?
pins: 2, 3, 4, 5, 6, 8

## TMC2242A
designator U?
footprint LQFP44
pins: 1 SO12, 2 SO11, 3 SO10, 4 SO9, 5 SO8, 6 GND, 7 VDD, 8 SO7, 9 SO6, 10 SO5, 11 SO4, 12 SO3, 13 SO2, 14 SO1, 15 SO0, 16 RND2, 17 RND1, 18 RND0, 19 SI0, 20 SI1, 21 SI2, 22 GND, 23 VDD, 24 SI3, 25 SI4, 26 SI5, 27 SI6, 28 SI7, 29 SI8, 30 SI9, 31 SI10, 32 VDD, 33 GND, 34 SI11, 35 GND, 36 CLK, 37 SYNC, 38 ~{INT}, 39 ~{DEC}, 40 TCO, 41 ~{OE}, 42 SO15, 43 SO14, 44 SO13

## TO 18
designator U?

## TO 39
designator U?

## TO 72
designator U?

## TO 92
designator U?

## TO 92A
designator U?

## TO 220
designator U?

## TO 237
designator U?

## TP4056
designator *
footprint so-8-ep
pins: 1 TEMP, 2 RPROG, 3 GND, 4 VCC, 5 BAT, 6 STDBY, 7 CHRG, 8 CE, 9 EP

## TPA6204A1DRBR
designator *
footprint TPA6204A1DRBR
pins: 1 ~{SHUTDOWN}, 2 BYPASS, 3 IN+, 4 IN-, 5 VO+, 6 VDD, 7 GND, 8 VO-, 9 EP_1, 10 EP_2, 11 EP_3, 12 EP_4, 13 EP_5

## TPD6E001
designator *
footprint UQFN10 (Footprint not found)
pins: 1 IO1, 2 IO2, 3 IO3, 4 N.C., 5 GND, 6 IO4, 7 IO5, 8 IO6, 9 N.C., 10 VCC

## TPD6F003DQDR
designator *
footprint DSV12 (Footprint not found)
pins: 1 INCh_1, 2 INCh_2, 3 INCh_3, 4 INCh_4, 5 INCh_5, 6 INCh_6, 7 OutCh_6, 8 OutCh_5, 9 OutCh_4, 10 OutCh_3, 11 OutCh_2, 12 OutCh_1, EP

## TPS2121
designator *
pins: 1 out, 2 in, 4 OV2, 5 OV1, 6 PR1, 7 in, 8 out, 9 status, 10 Current Limiting, 11 Soft Start, 12 GND

## TPS54260DGQR
designator U?
footprint S_XTR111AIDGQR
pins: 1 BOOT (out), 2 VIN (in), 3 EN (in), 4 SS/TR (in), 5 RT/CLK (in), 6 PWRGD (out), 7 VSENSE (in), 8 COMP (out), 9 GND (power), 10 PH (in), 11 EP (io)

## TPS63070
designator U?
footprint VQFN15 (Footprint not found)
pins: 1 PS/S, 2 PG, 3 VAUX, 4 GND, 5 FB, 6 FB2, 7 VOUT, 8 VOUT, 9 L2, 10 PGND, 11 L1, 12 VIN, 13 VIN, 14 EN, 15 VSEL(Tune Output)

## TR
designator TR
pins: 1, 2, 3

## TRANS1
designator ?
pins: 1, 2, 3, 4

## TRANS2
designator ?
pins: 1, 2, 3, 4

## TRANS3
designator ?
pins: 1, 2, 3, 4

## TRANS4
designator ?
pins: 1, 2, 3, 4, 5

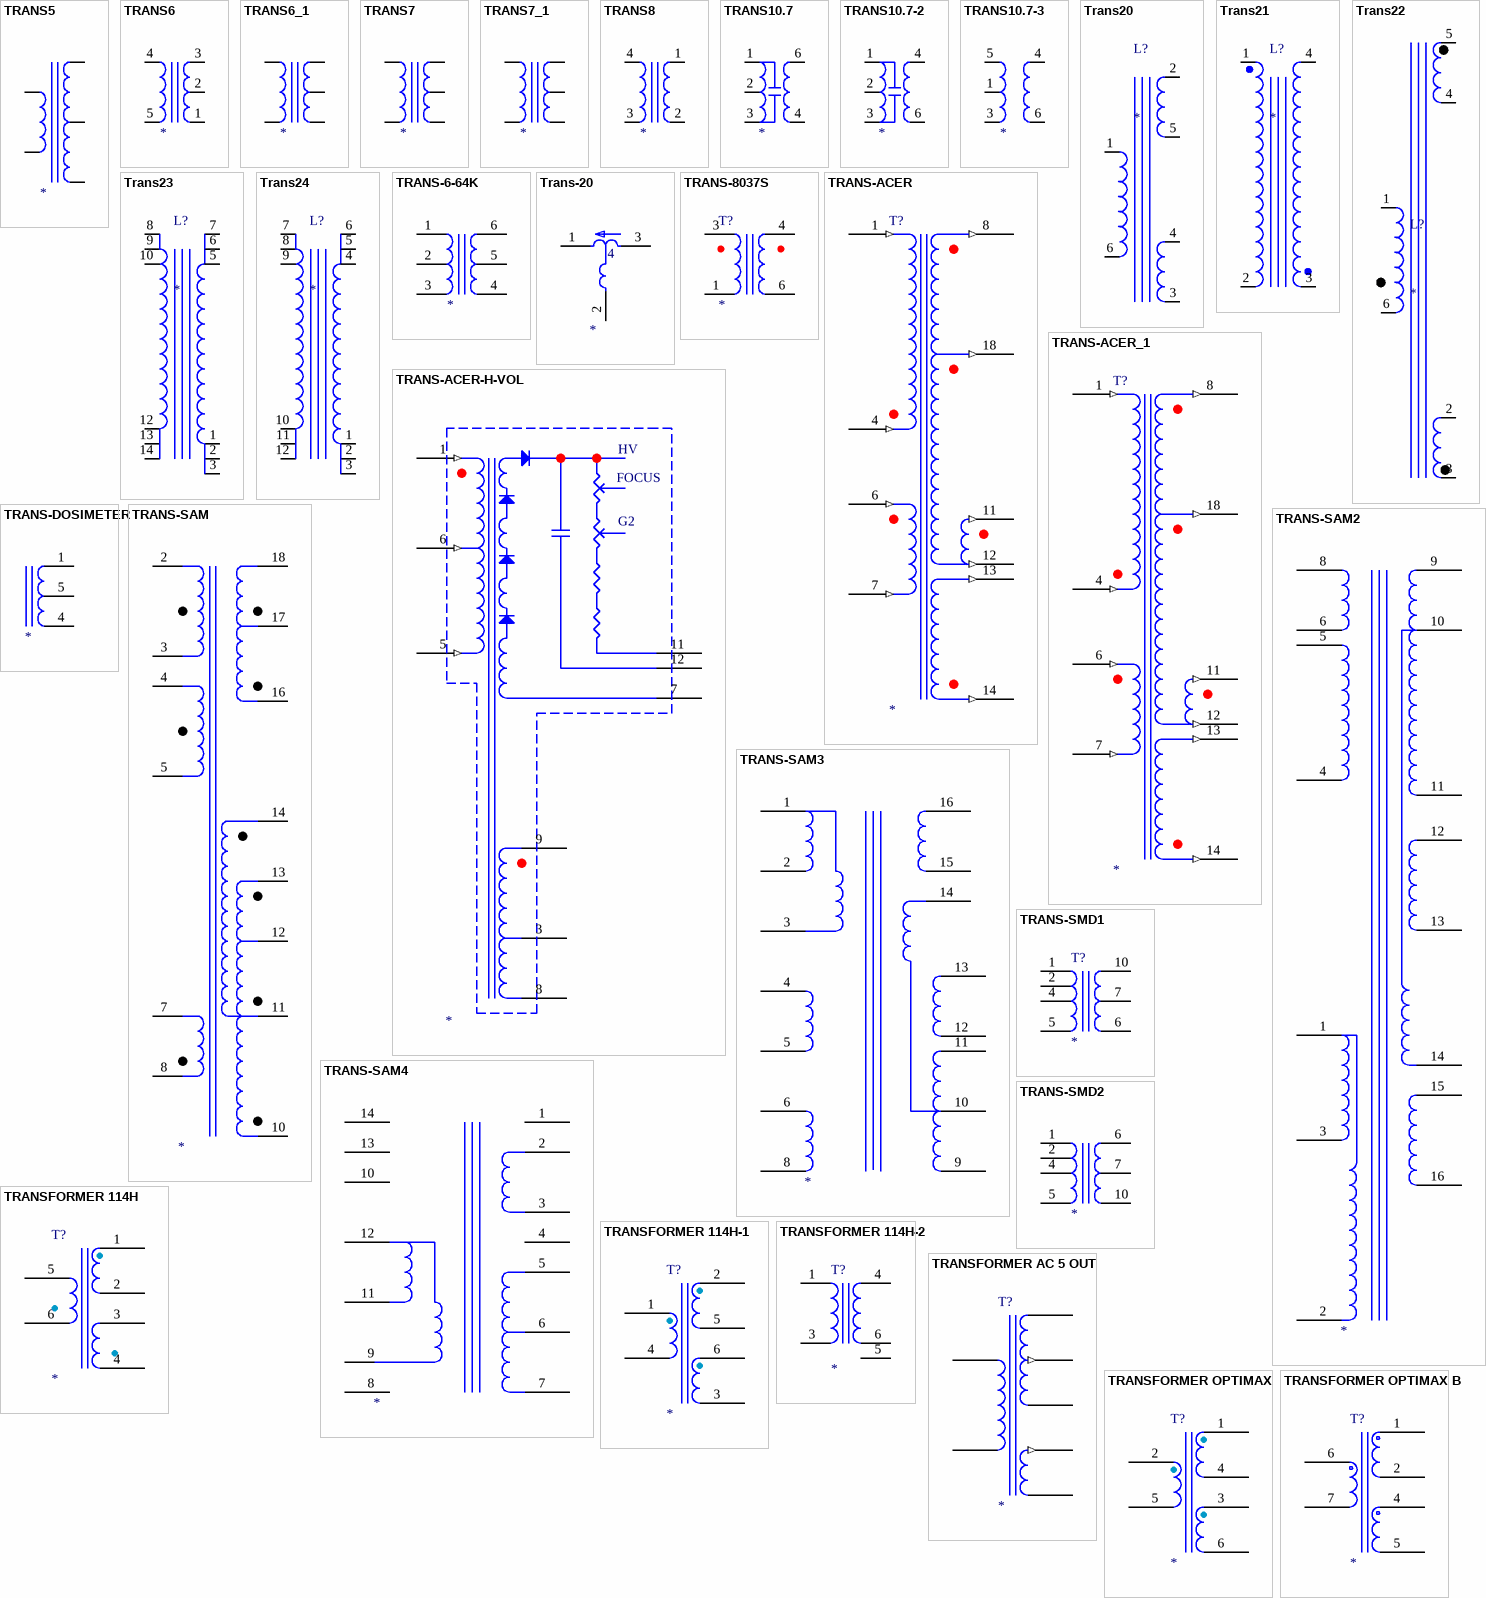
[diagram p73: symbols TRANS5 to TRANSFORMER OPTIMAX B]

## TRANS5
designator ?
pins: 1, 2, 3, 4, 5

## TRANS6
designator ?
pins: 1, 2, 3, 4, 5

## TRANS6_1
designator ?
pins: 1, 2, 3, 4, 6

## TRANS7
designator ?
pins: 1, 2, 3, 4, 6

## TRANS7_1
designator ?
pins: 1, 2, 3, 4, 6

## TRANS8
designator ?
pins: 1, 2, 3, 4

## TRANS10.7
designator ?
pins: 1, 2, 3, 4, 6

## TRANS10.7-2
designator ?
pins: 1, 2, 3, 4, 6

## TRANS10.7-3
designator ?
pins: 1, 3, 4, 5, 6

## Trans20
designator L?
pins: 1, 2, 3, 4, 5, 6

## Trans21
designator L?
pins: 1, 2, 3, 4

## Trans22
designator L?
pins: 1, 2, 3, 4, 5, 6

## Trans23
designator L?
pins: 1, 2, 3, 5, 6, 7, 8, 9, 10, 12, 13, 14

## Trans24
designator L?
pins: 1, 2, 3, 4, 5, 6, 7, 8, 9, 10, 11, 12

## TRANS-6-64K
designator ?
pins: 1, 2, 3, 4, 5, 6

## Trans-20
designator ?
pins: 1, 2, 3
text: 4

## TRANS-8037S
designator T?
footprint TRANS-8037S
pins: 1, 3, 4, 6

## TRANS-ACER
designator T?
pins: 1 (in), 4 (in), 6 (in), 7 (in), 8 (out), 11 (out), 12 (out), 13 (out), 14 (out), 18 (out)

## TRANS-ACER-H-VOL
designator ?
pins: 1 (in), 3, 5 (in), 6 (in), 7, 8, 9, 11, 12
text: HV; FOCUS; G2

## TRANS-ACER_1
designator T?
pins: 1 (in), 4 (in), 6 (in), 7 (in), 8 (out), 11 (out), 12 (out), 13 (out), 14 (out), 18 (out)

## TRANS-DOSIMETER
designator ?
pins: 1, 4, 5

## TRANS-SAM
designator ?
pins: 2, 3, 4, 5, 7, 8, 10, 11, 12, 13, 14, 16, 17, 18

## TRANS-SAM2
designator ?
pins: 1, 2, 3, 4, 5, 6, 8, 9, 10, 11, 12, 13, 14, 15, 16

## TRANS-SAM3
designator ?
pins: 1, 2, 3, 4, 5, 6, 8, 9, 10, 11, 12, 13, 14, 15, 16

## TRANS-SAM4
designator ?
pins: 1, 2, 3, 4, 5, 6, 7, 8, 9, 10, 11, 12, 13, 14

## TRANS-SMD1
designator T?
pins: 1, 2, 4, 5, 6, 7, 10

## TRANS-SMD2
designator ?
pins: 1, 2, 4, 5, 6, 7, 10

## TRANSFORMER 114H
designator T?
pins: 1 A1, 2 A2, 3 C1, 4 C2, 5 B1, 6 B2

## TRANSFORMER 114H-1
designator T?
pins: 1 B1, 2 A1, 3 C2, 4 B2, 5 A2, 6 C1

## TRANSFORMER 114H-2
designator T?
footprint 114H1-TDK-2
pins: 1 B1, 3 B2, 4 A1, 5 C2, 6 A2

## TRANSFORMER AC 5 OUT
designator T?
pins: IN1, IN2, OUT1, OUT2 (out), OUT3, OUT4 (out), OUT5

## TRANSFORMER OPTIMAX
designator T?
pins: 1 A1, 2 B1, 3 C1, 4 A2, 5 B2, 6 C2

## TRANSFORMER OPTIMAX B
designator T?
pins: 1, 2, 4 14, 5, 6, 7

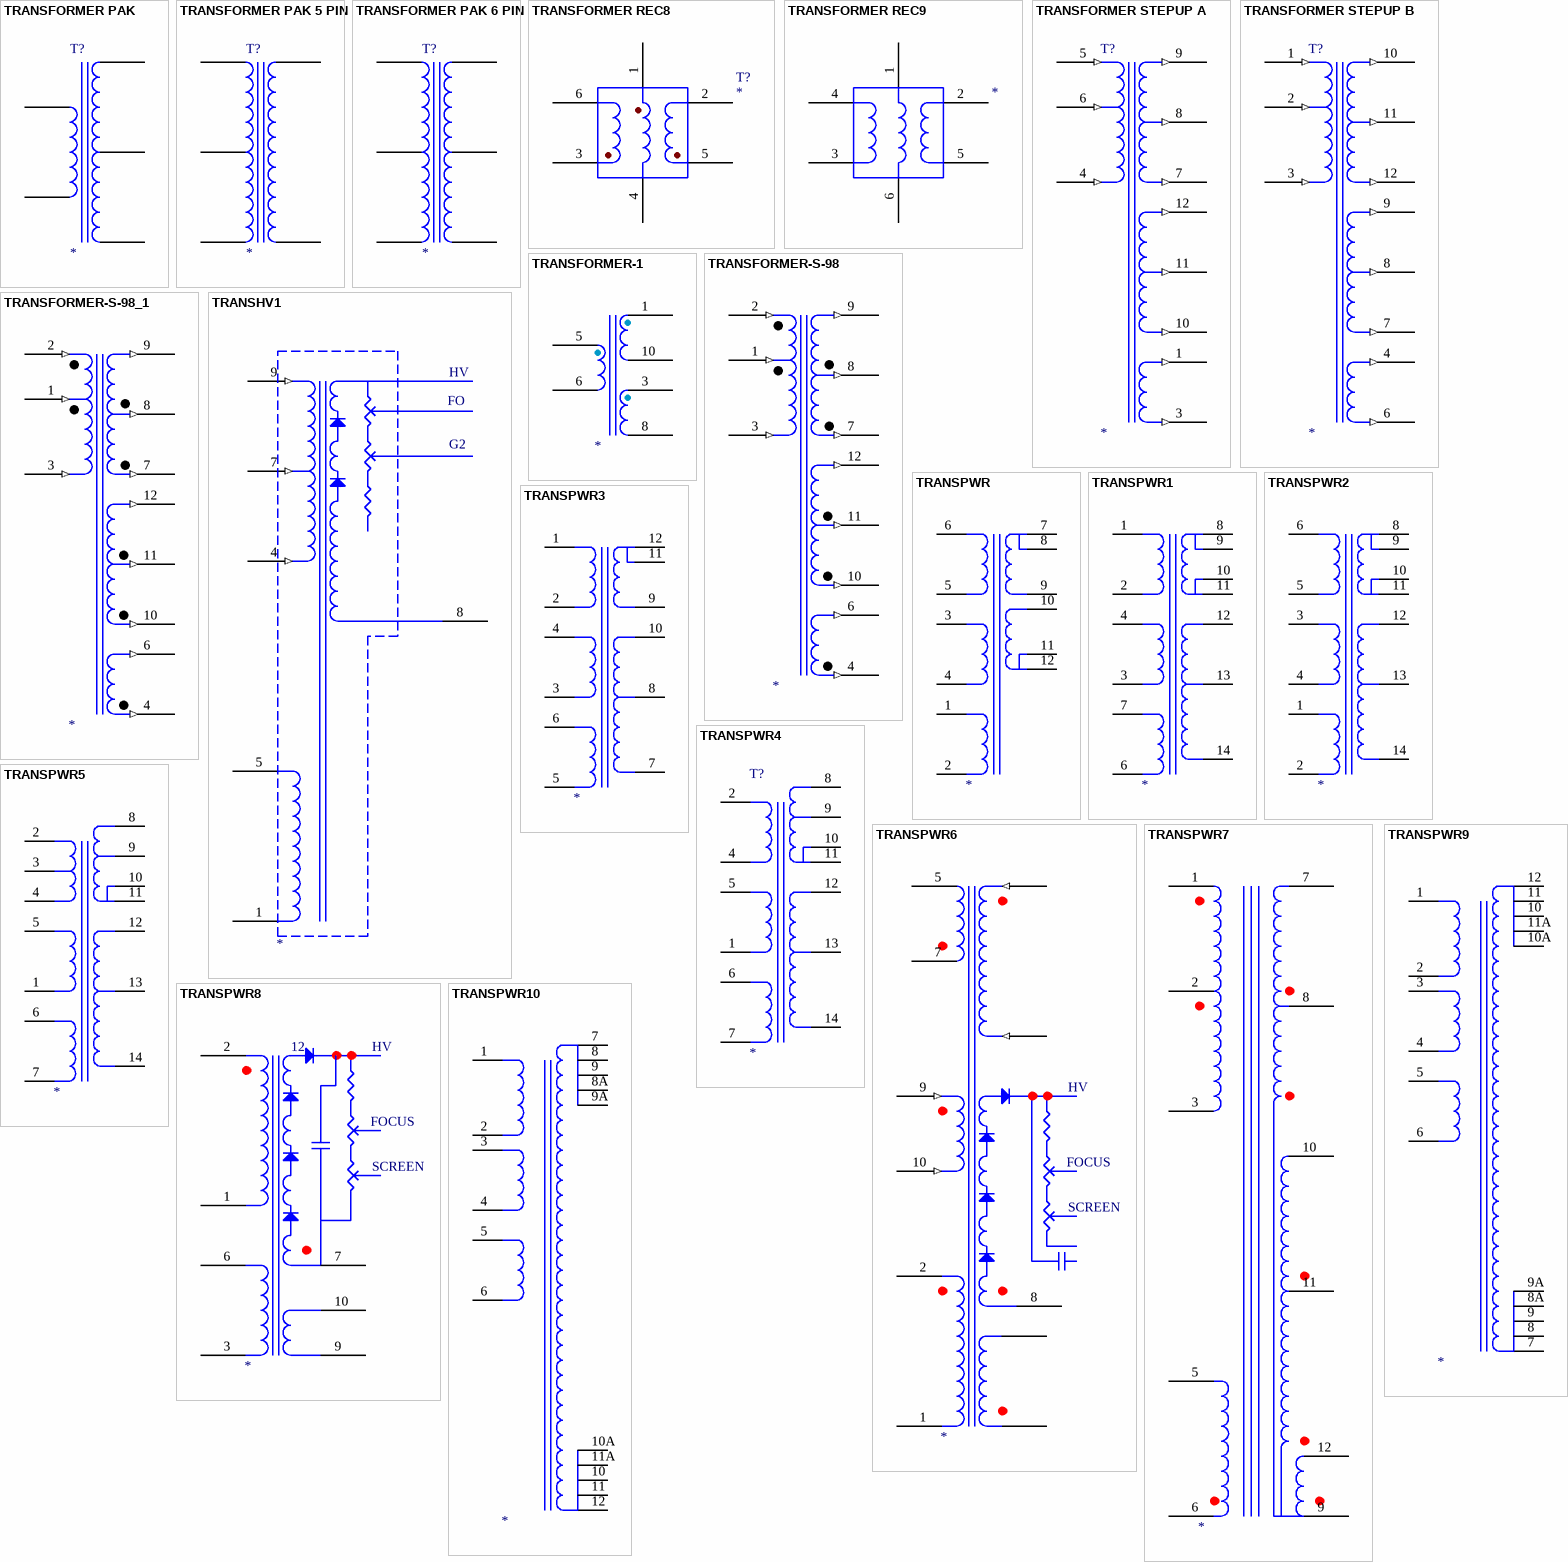
[diagram p74: symbols TRANSFORMER PAK to TRANSPWR10]

## TRANSFORMER PAK
designator T?
pins: A1, A2, B1, B2, B3

## TRANSFORMER PAK 5 PIN
designator T?
pins: A, B, C, D, E

## TRANSFORMER PAK 6 PIN
designator T?
pins: A, B, C, D, E, F

## TRANSFORMER REC8
designator T?
pins: 1 A, 2 B, 3 C, 4 D, 5 E, 6 F

## TRANSFORMER REC9
designator ?
pins: 1 A, 2 B, 3 C, 4 D, 5 E, 6 F

## TRANSFORMER STEPUP A
designator T?
pins: 1 OUT7 (out), 3 OUT8 (out), 4 IN3 (in), 5 OUT9 (in), 6 IN2 (in), 7 OUT3 (out), 8 OUT2 (out), 9 OUT1 (out), 10 OUT6 (out), 11 OUT5 (out), 12 OUT4 (out)

## TRANSFORMER STEPUP B
designator T?
pins: 1 OUT9 (in), 2 IN2 (in), 3 IN3 (in), 4 OUT7 (out), 6 OUT8 (out), 7 OUT6 (out), 8 OUT5 (out), 9 OUT4 (out), 10 OUT1 (out), 11 OUT2 (out), 12 OUT3 (out)

## TRANSFORMER-1
designator ?
pins: 1, 3 C1, 5 B1, 6 B2, 8 C2, 10 A2

## TRANSFORMER-S-98
designator ?
pins: 1 IN2 (in), 2 OUT9 (in), 3 IN3 (in), 4 OUT8 (out), 6 OUT7 (out), 7 OUT3 (out), 8 OUT2 (out), 9 OUT1 (out), 10 OUT6 (out), 11 OUT5 (out), 12 OUT4 (out)

## TRANSFORMER-S-98_1
designator ?
pins: 1 IN2 (in), 2 OUT9 (in), 3 IN3 (in), 4 OUT8 (out), 6 OUT7 (out), 7 OUT3 (out), 8 OUT2 (out), 9 OUT1 (out), 10 OUT6 (out), 11 OUT5 (out), 12 OUT4 (out)

## TRANSHV1
designator ?
pins: 1, 4 (in), 5, 7 (in), 8, 9 (in)
text: HV; FO; G2

## TRANSPWR
designator ?
pins: 1, 2, 3, 4, 5, 6, 7, 8, 9, 10, 11, 12

## TRANSPWR1
designator ?
pins: 1, 2, 3, 4, 6, 7, 8, 9, 10, 11, 12, 13, 14

## TRANSPWR2
designator ?
pins: 1, 2, 3, 4, 5, 6, 8, 9, 10, 11, 12, 13, 14

## TRANSPWR3
designator ?
pins: 1, 2, 3, 4, 5, 6, 7, 8, 9, 10, 11, 12

## TRANSPWR4
designator T?
T?
pins: 1, 2, 4, 5, 6, 7, 8, 9, 10, 11, 12, 13, 14

## TRANSPWR5
designator ?
pins: 1, 2, 3 0, 4, 5, 6, 7, 8, 9, 10, 11, 12, 13, 14

## TRANSPWR6
designator ?
pins: 1, 2, 5, 7, 8, 9 (in), 10 (in), ?1, ?2, ?3 (in), ?4 (in)
text: HV; FOCUS; SCREEN

## TRANSPWR7
designator ?
pins: 1, 2, 3, 5, 6, 7, 8, 9, 10, 11, 12

## TRANSPWR8
designator ?
pins: 1, 2, 3, 6, 7, 9, 10
text: 12; HV; FOCUS; SCREEN

## TRANSPWR9
designator ?
pins: 1, 2, 3 0, 4, 5, 6, 7, 8, 8A, 9, 9A, 10, 10A, 11, 11A, 12

## TRANSPWR10
designator ?
pins: 1, 2, 3 0, 4, 5, 6, 7, 8, 8A, 9, 9A, 10, 10A, 11, 11A, 12

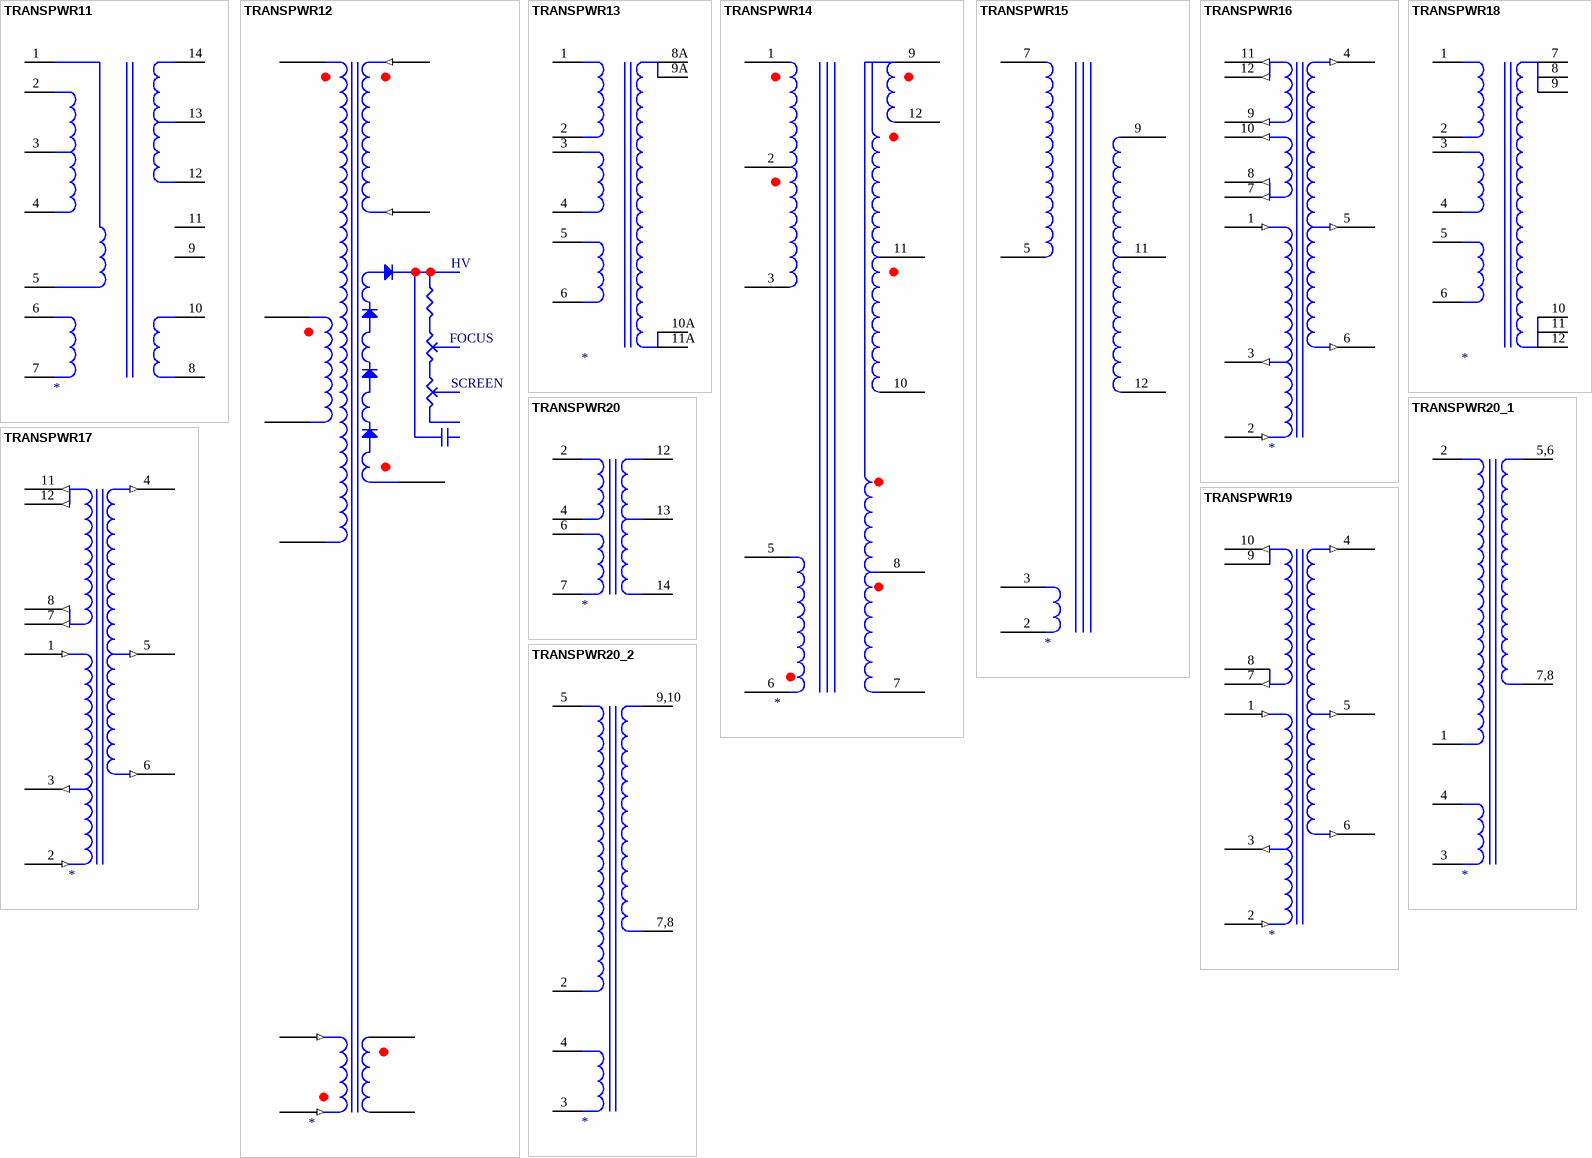
[diagram p75: symbols TRANSPWR11 to TRANSPWR20_2]

## TRANSPWR11
designator ?
pins: 1, 2, 3 0, 4, 5, 6, 7, 8, 9, 10, 11, 12, 13, 14

## TRANSPWR12
designator ?
pins: ?1 (in), ?2 (in), ?3, ?4, ?5, ?6, ?7, ?8 (in), ?9 (in), ?10, ?11
text: HV; FOCUS; SCREEN

## TRANSPWR13
designator ?
pins: 1, 2, 3 0, 4, 5, 6, 8A, 9A, 10A, 11A

## TRANSPWR14
designator ?
pins: 1, 2, 3, 5, 6, 7, 8, 9, 10, 11, 12

## TRANSPWR15
designator ?
pins: 2, 3, 5, 7, 9, 11, 12

## TRANSPWR16
designator ?
pins: 1 OUT9 (in), 2 IN3 (in), 3 OUT7 (out), 4 OUT2 (out), 5 OUT1 (out), 6 OUT3 (out), 7 OUT4 (out), 8 OUT4 (out), 9 OUT4 (out), 10 OUT4 (out), 11 OUT5 (out), 12 OUT4 (out)

## TRANSPWR17
designator ?
pins: 1 OUT9 (in), 2 IN3 (in), 3 OUT7 (out), 4 OUT2 (out), 5 OUT1 (out), 6 OUT3 (out), 7 OUT4 (out), 8 OUT4 (out), 11 OUT5 (out), 12 OUT4 (out)

## TRANSPWR18
designator ?
pins: 1, 2, 3 0, 4, 5, 6, 7, 8, 9, 10, 11, 12

## TRANSPWR19
designator ?
pins: 1 OUT9 (in), 2 IN3 (in), 3 OUT7 (out), 4 OUT2 (out), 5 OUT1 (out), 6 OUT3 (out), 7 OUT4 (out), 8, 9, 10 (out)

## TRANSPWR20
designator ?
pins: 2, 4, 6, 7, 12, 13, 14

## TRANSPWR20_1
designator ?
pins: 1, 2, 3, 4, 5,6, 7,8

## TRANSPWR20_2
designator ?
pins: 2, 3, 4, 5, 7,8, 9,10

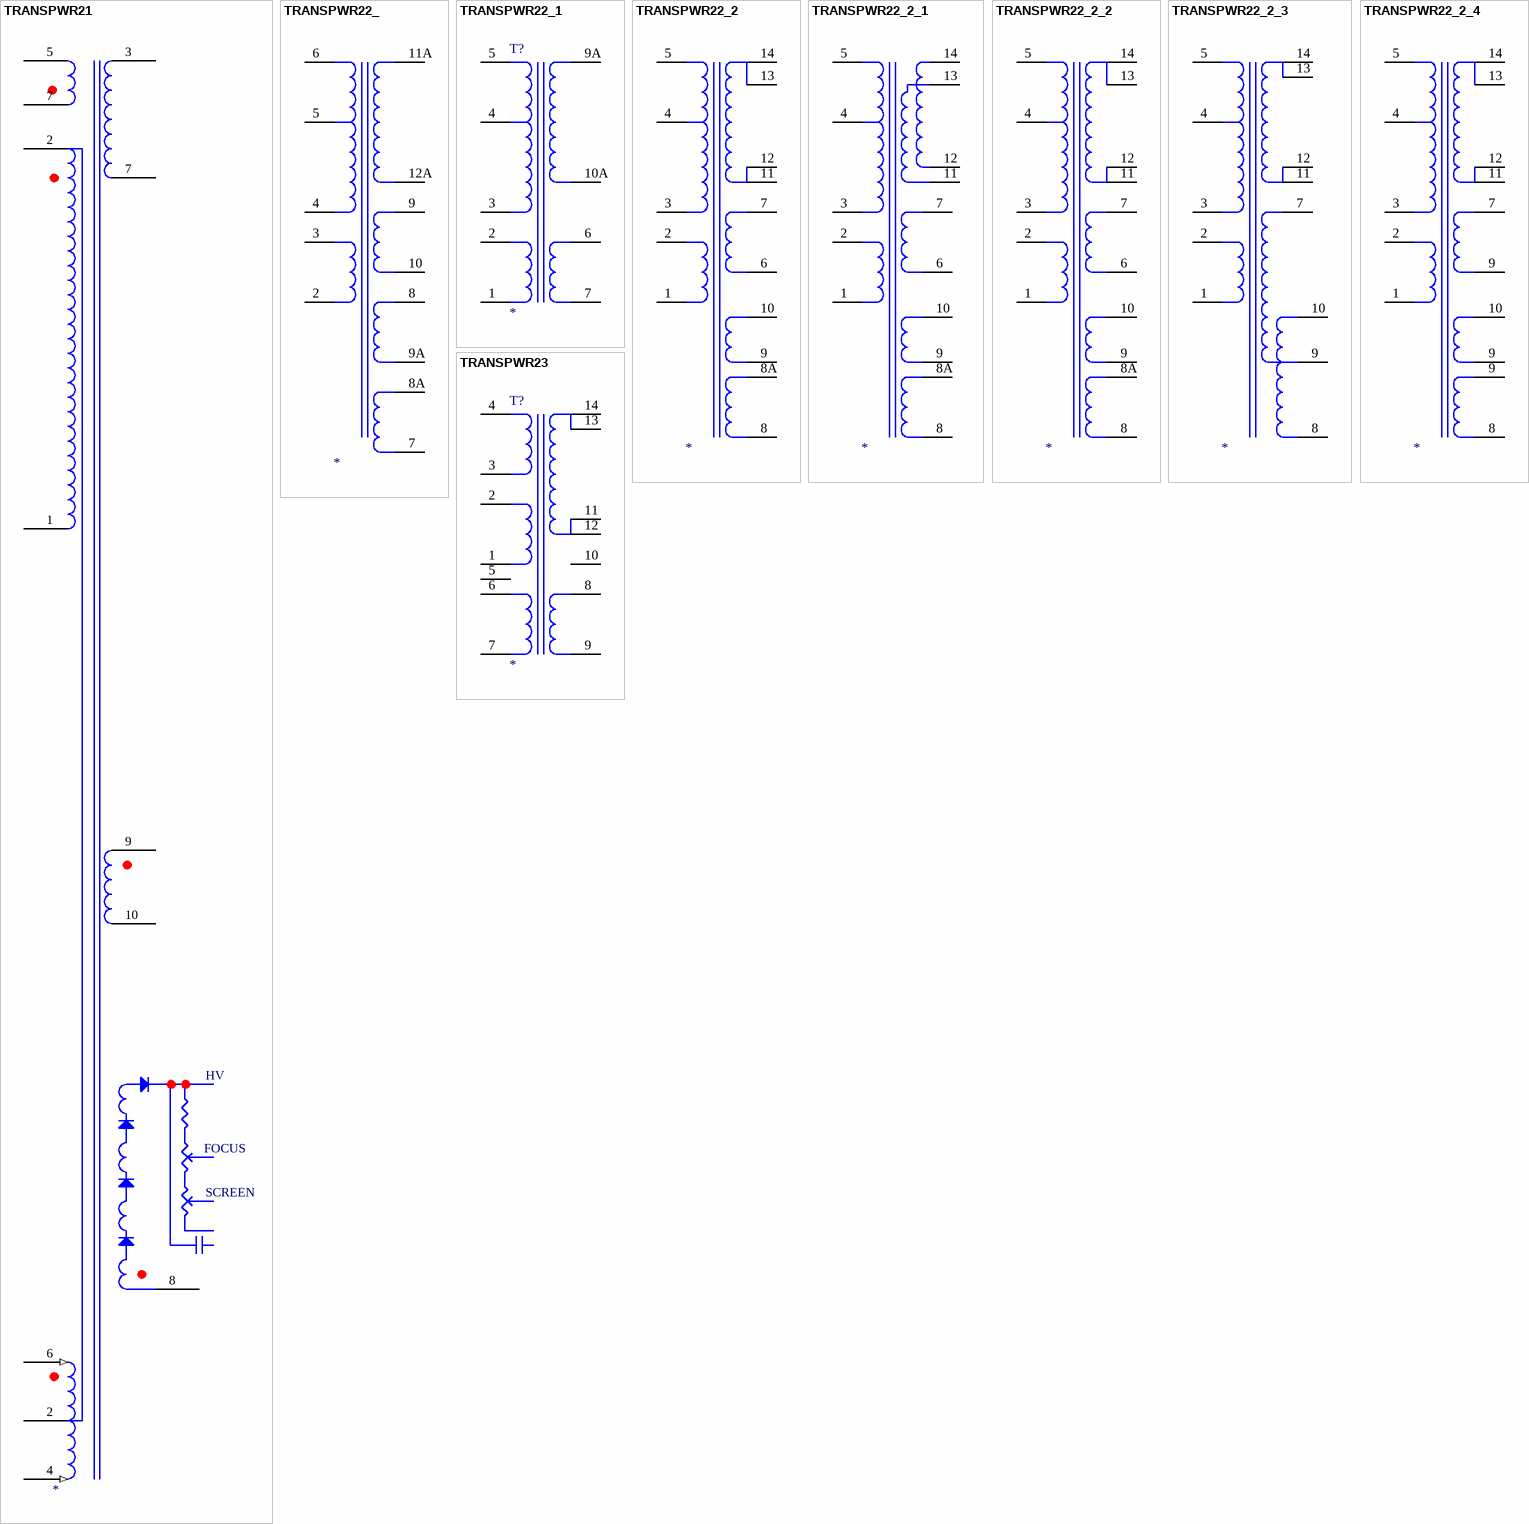
[diagram p76: symbols TRANSPWR21 to TRANSPWR23]

## TRANSPWR21
designator ?
pins: 1, 2, 2, 3, 4 (in), 5, 6 (in), 7, 7, 8, 9, 10
text: HV; FOCUS; SCREEN

## TRANSPWR22_
designator ?
pins: 2, 3, 4, 5 0, 6, 7, 8, 8A, 9, 9A, 10, 11A, 12A

## TRANSPWR22_1
designator T?
footprint EI3026B
pins: 1, 2, 3, 4, 5, 6, 7, 9A, 10A

## TRANSPWR22_2
designator ?
pins: 1, 2, 3, 4 0, 5, 6, 7, 8, 8A, 9, 10, 11, 12, 13, 14

## TRANSPWR22_2_1
designator ?
pins: 1, 2, 3, 4 0, 5, 6, 7, 8, 8A, 9, 10, 11, 12, 13, 14

## TRANSPWR22_2_2
designator ?
pins: 1, 2, 3, 4 0, 5, 6, 7, 8, 8A, 9, 10, 11, 12, 13, 14

## TRANSPWR22_2_3
designator ?
pins: 1, 2, 3, 4 0, 5, 7, 8, 9, 10, 11, 12, 13, 14

## TRANSPWR22_2_4
designator ?
pins: 1, 2, 3, 4 0, 5, 7, 8, 9, 9, 9, 10, 11, 12, 13, 14

## TRANSPWR23
designator T?
footprint TRANSPWR2
pins: 1, 2, 3 0, 4, 5, 6, 7, 8, 9, 10, 11, 12, 13, 14

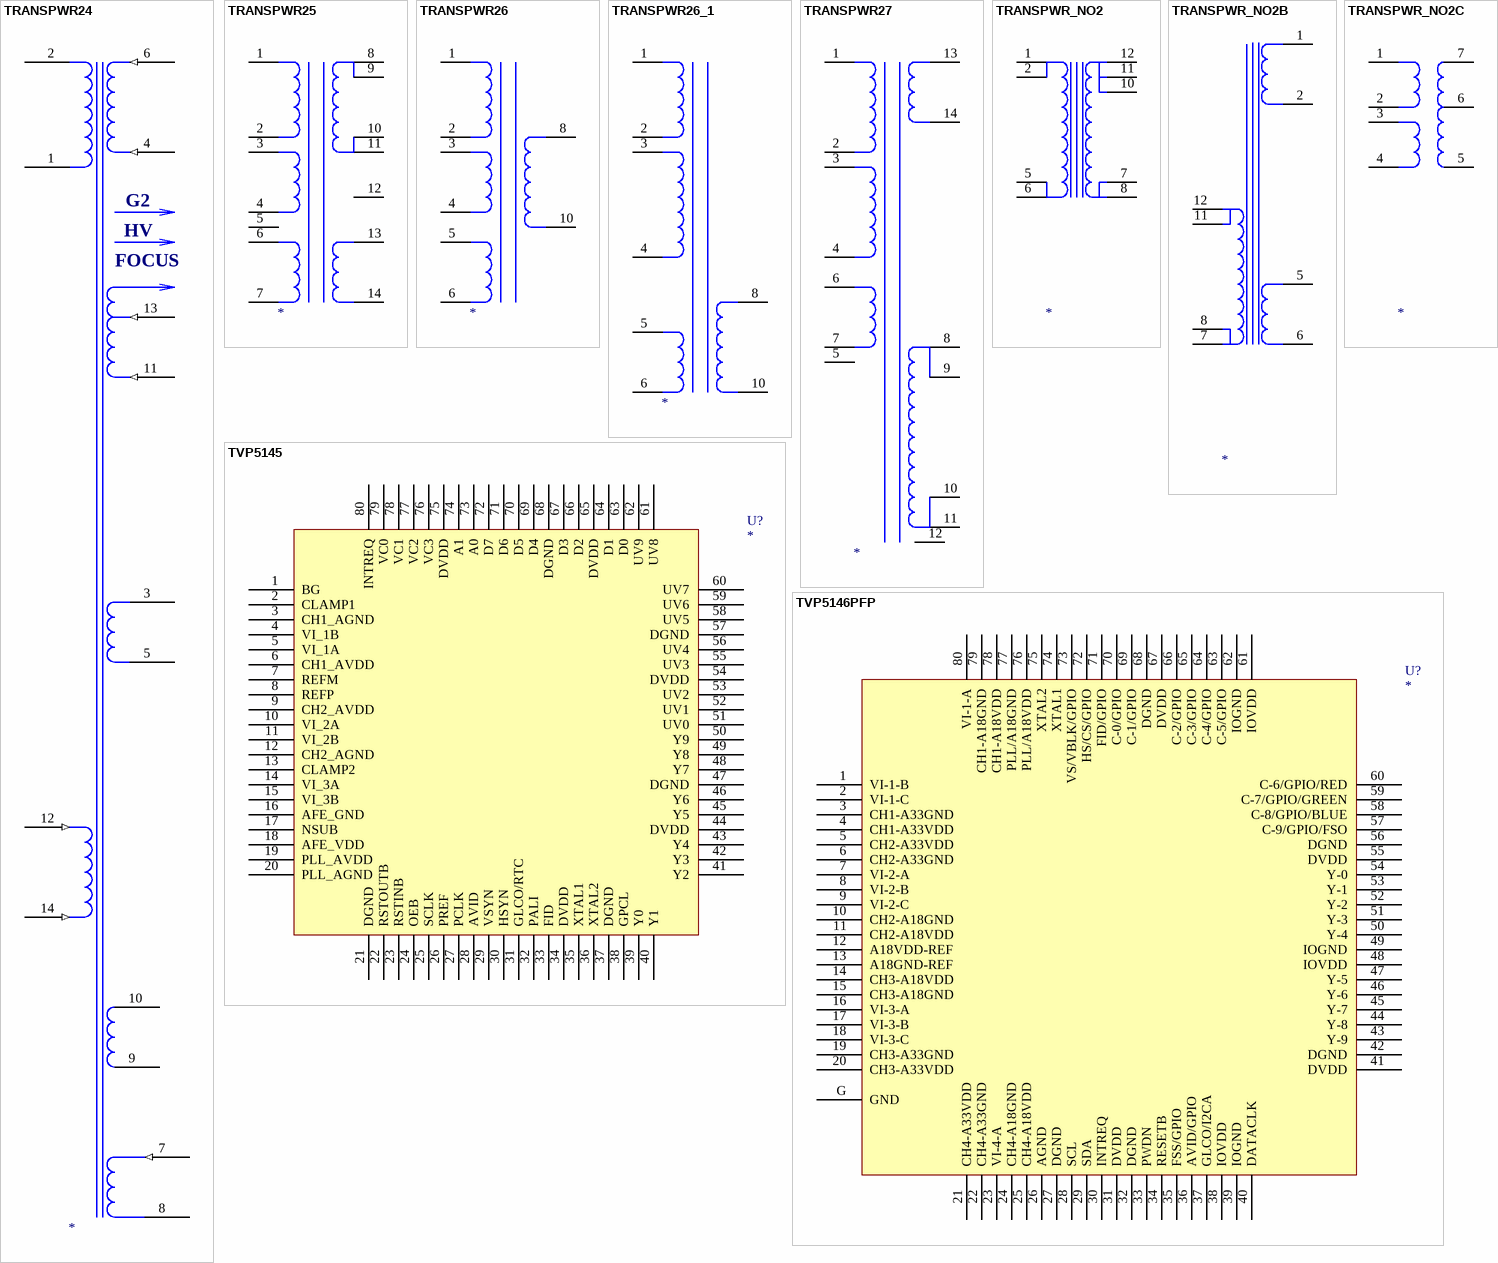
[diagram p77: symbols TRANSPWR24 to TVP5146PFP]

## TRANSPWR24
designator ?
pins: 1, 2, 3, 4 (in), 5, 6 (in), 7 (in), 8, 9, 10, 11 (in), 12 (in), 13 (in), 14 (in)
text: G2; HV; FOCUS

## TRANSPWR25
designator ?
pins: 1, 2, 3 0, 4, 5, 6, 7, 8, 9, 10, 11, 12, 13, 14

## TRANSPWR26
designator ?
pins: 1, 2, 3 0, 4, 5, 6, 8, 10

## TRANSPWR26_1
designator ?
pins: 1, 2, 3 0, 4, 5, 6, 8, 10

## TRANSPWR27
designator ?
pins: 1, 2, 3 0, 4, 5, 6, 7, 8, 9, 10, 11, 12, 13, 14

## TRANSPWR_NO2
designator ?
pins: 1, 2, 5, 6, 7, 8, 10, 11, 12

## TRANSPWR_NO2B
designator ?
pins: 1, 2, 5, 6, 7, 8, 11, 12

## TRANSPWR_NO2C
designator ?
pins: 1, 2, 3, 4, 5, 6, 7

## TVP5145
designator U?
footprint PQFP-G80
pins: 1 BG, 2 CLAMP1, 3 CH1_AGND, 4 VI_1B, 5 VI_1A, 6 CH1_AVDD, 7 REFM, 8 REFP, 9 CH2_AVDD, 10 VI_2A, 11 VI_2B, 12 CH2_AGND, 13 CLAMP2, 14 VI_3A, 15 VI_3B, 16 AFE_GND, 17 NSUB, 18 AFE_VDD, 19 PLL_AVDD, 20 PLL_AGND, 21 DGND, 22 RSTOUTB, 23 RSTINB, 24 OEB, 25 SCLK, 26 PREF, 27 PCLK, 28 AVID, 29 VSYN, 30 HSYN, 31 GLCO/RTC, 32 PALI, 33 FID, 34 DVDD, 35 XTAL1, 36 XTAL2, 37 DGND, 38 GPCL, 39 Y0, 40 Y1, 41 Y2, 42 Y3, 43 Y4, 44 DVDD, 45 Y5, 46 Y6, 47 DGND, 48 Y7, 49 Y8, 50 Y9, 51 UV0, 52 UV1, 53 UV2, 54 DVDD, 55 UV3, 56 UV4, 57 DGND, 58 UV5, 59 UV6, 60 UV7, 61 UV8, 62 UV9, 63 D0, 64 D1, 65 DVDD, 66 D2, 67 D3, 68 DGND, 69 D4, 70 D5, 71 D6, 72 D7, 73 A0, 74 A1, 75 DVDD, 76 VC3, 77 VC2, 78 VC1, 79 VC0, 80 INTREQ

## TVP5146PFP
designator U?
footprint PQFP-G80
pins: 1 VI-1-B, 2 VI-1-C, 3 CH1-A33GND, 4 CH1-A33VDD, 5 CH2-A33VDD, 6 CH2-A33GND, 7 VI-2-A, 8 VI-2-B, 9 VI-2-C, 10 CH2-A18GND, 11 CH2-A18VDD, 12 A18VDD-REF, 13 A18GND-REF, 14 CH3-A18VDD, 15 CH3-A18GND, 16 VI-3-A, 17 VI-3-B, 18 VI-3-C, 19 CH3-A33GND, 20 CH3-A33VDD, 21 CH4-A33VDD, 22 CH4-A33GND, 23 VI-4-A, 24 CH4-A18GND, 25 CH4-A18VDD, 26 AGND, 27 DGND, 28 SCL, 29 SDA, 30 INTREQ, 31 DVDD, 32 DGND, 33 PWDN, 34 RESETB, 35 FSS/GPIO, 36 AVID/GPIO, 37 GLCO/I2CA, 38 IOVDD, 39 IOGND, 40 DATACLK, 41 DVDD, 42 DGND, 43 Y-9, 44 Y-8, 45 Y-7, 46 Y-6, 47 Y-5, 48 IOVDD, 49 IOGND, 50 Y-4, 51 Y-3, 52 Y-2, 53 Y-1, 54 Y-0, 55 DVDD, 56 DGND, 57 C-9/GPIO/FSO, 58 C-8/GPIO/BLUE, 59 C-7/GPIO/GREEN, 60 C-6/GPIO/RED, 61 IOVDD, 62 IOGND, 63 C-5/GPIO, 64 C-4/GPIO, 65 C-3/GPIO, 66 C-2/GPIO, 67 DVDD, 68 DGND, 69 C-1/GPIO, 70 C-0/GPIO, 71 FID/GPIO, 72 HS/CS/GPIO, 73 VS/VBLK/GPIO, 74 XTAL1, 75 XTAL2, 76 PLL/A18VDD, 77 PLL/A18GND, 78 CH1-A18VDD, 79 CH1-A18GND, 80 VI-1-A, G GND

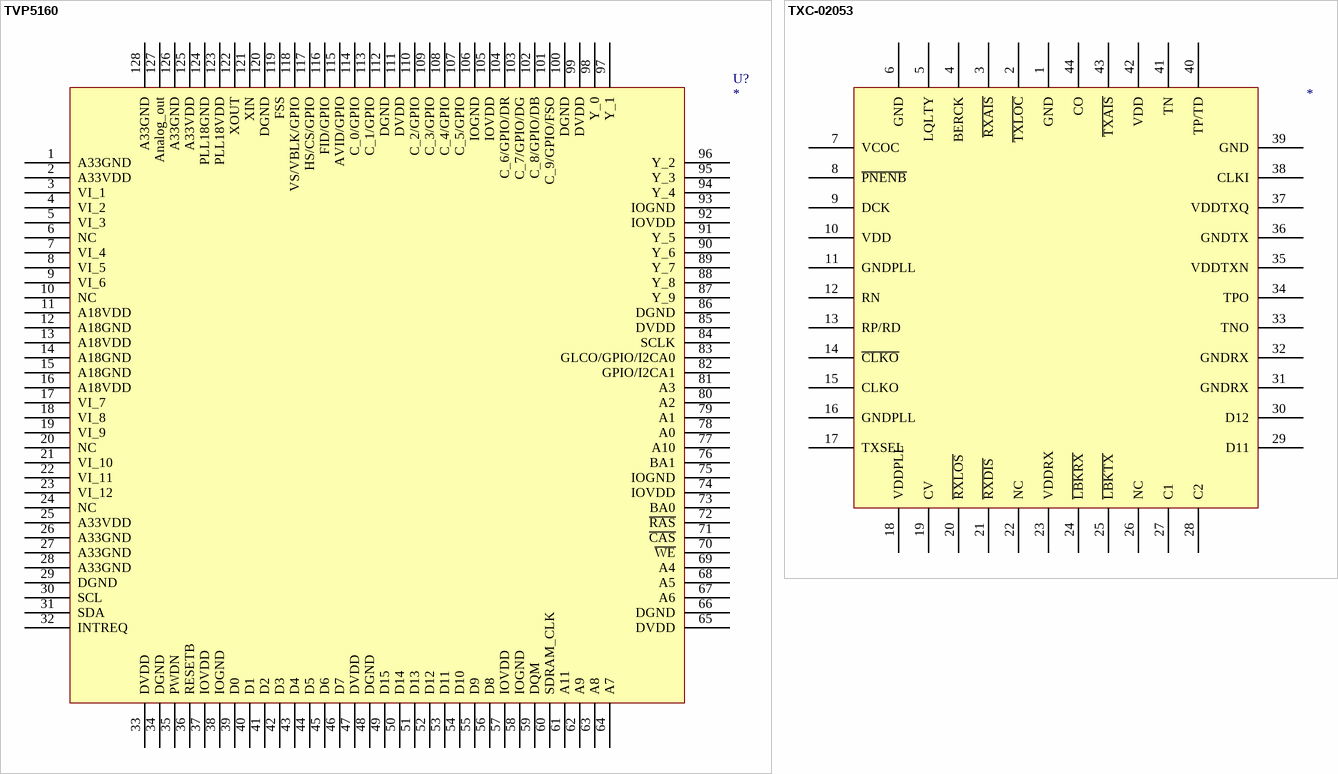
[diagram p78: symbols TVP5160 to TXC-02053]

## TVP5160
designator U?
footprint S-PQFP-G128
pins: 1 A33GND, 2 A33VDD, 3 VI_1, 4 VI_2, 5 VI_3, 6 NC, 7 VI_4, 8 VI_5, 9 VI_6, 10 NC, 11 A18VDD, 12 A18GND, 13 A18VDD, 14 A18GND, 15 A18GND, 16 A18VDD, 17 VI_7, 18 VI_8, 19 VI_9, 20 NC, 21 VI_10, 22 VI_11, 23 VI_12, 24 NC, 25 A33VDD, 26 A33GND, 27 A33GND, 28 A33GND, 29 DGND, 30 SCL, 31 SDA, 32 INTREQ, 33 DVDD, 34 DGND, 35 PWDN, 36 RESETB, 37 IOVDD, 38 IOGND, 39 D0, 40 D1, 41 D2, 42 D3, 43 D4, 44 D5, 45 D6, 46 D7, 47 DVDD, 48 DGND, 49 D15, 50 D14, 51 D13, 52 D12, 53 D11, 54 D10, 55 D9, 56 D8, 57 IOVDD, 58 IOGND, 59 DQM, 60 SDRAM_CLK, 61 A11, 62 A9, 63 A8, 64 A7, 65 DVDD, 66 DGND, 67 A6, 68 A5, 69 A4, 70 ~{WE}, 71 ~{CAS}, 72 ~{RAS}, 73 BA0, 74 IOVDD, 75 IOGND, 76 BA1, 77 A10, 78 A0, 79 A1, 80 A2, 81 A3, 82 GPIO/I2CA1, 83 GLCO/GPIO/I2CA0, 84 SCLK, 85 DVDD, 86 DGND, 87 Y_9, 88 Y_8, 89 Y_7, 90 Y_6, 91 Y_5, 92 IOVDD, 93 IOGND, 94 Y_4, 95 Y_3, 96 Y_2, 97 Y_1, 98 Y_0, 99 DVDD, 100 DGND, 101 C_9/GPIO/FSO, 102 C_8/GPIO/DB, 103 C_7/GPIO/DG, 104 C_6/GPIO/DR, 105 IOVDD, 106 IOGND, 107 C_5/GPIO, 108 C_4/GPIO, 109 C_3/GPIO, 110 C_2/GPIO, 111 DVDD, 112 DGND, 113 C_1/GPIO, 114 C_0/GPIO, 115 AVID/GPIO, 116 FID/GPIO, 117 HS/CS/GPIO, 118 VS/VBLK/GPIO, 119 FSS, 120 DGND, 121 XIN, 122 XOUT, 123 PLL18VDD, 124 PLL18GND, 125 A33VDD, 126 A33GND, 127 Analog_out, 128 A33GND

## TXC-02053
designator ?
U?
pins: 1 GND, 2 ~{TXLOC}, 3 ~{RXAIS}, 4 BERCK, 5 LQLTY, 6 GND, 7 VCOC, 8 ~{PNENB}, 9 DCK, 10 VDD, 11 GNDPLL, 12 RN, 13 RP/RD, 14 ~{CLKO}, 15 CLKO, 16 GNDPLL, 17 TXSEL, 18 VDDPLL, 19 CV, 20 ~{RXLOS}, 21 ~{RXDIS}, 22 NC, 23 VDDRX, 24 ~{LBKRX}, 25 ~{LBKTX}, 26 NC, 27 C1, 28 C2, 29 D11, 30 D12, 31 GNDRX, 32 GNDRX, 33 TNO, 34 TPO, 35 VDDTXN, 36 GNDTX, 37 VDDTXQ, 38 CLKI, 39 GND, 40 TP/TD, 41 TN, 42 VDD, 43 ~{TXAIS}, 44 CO

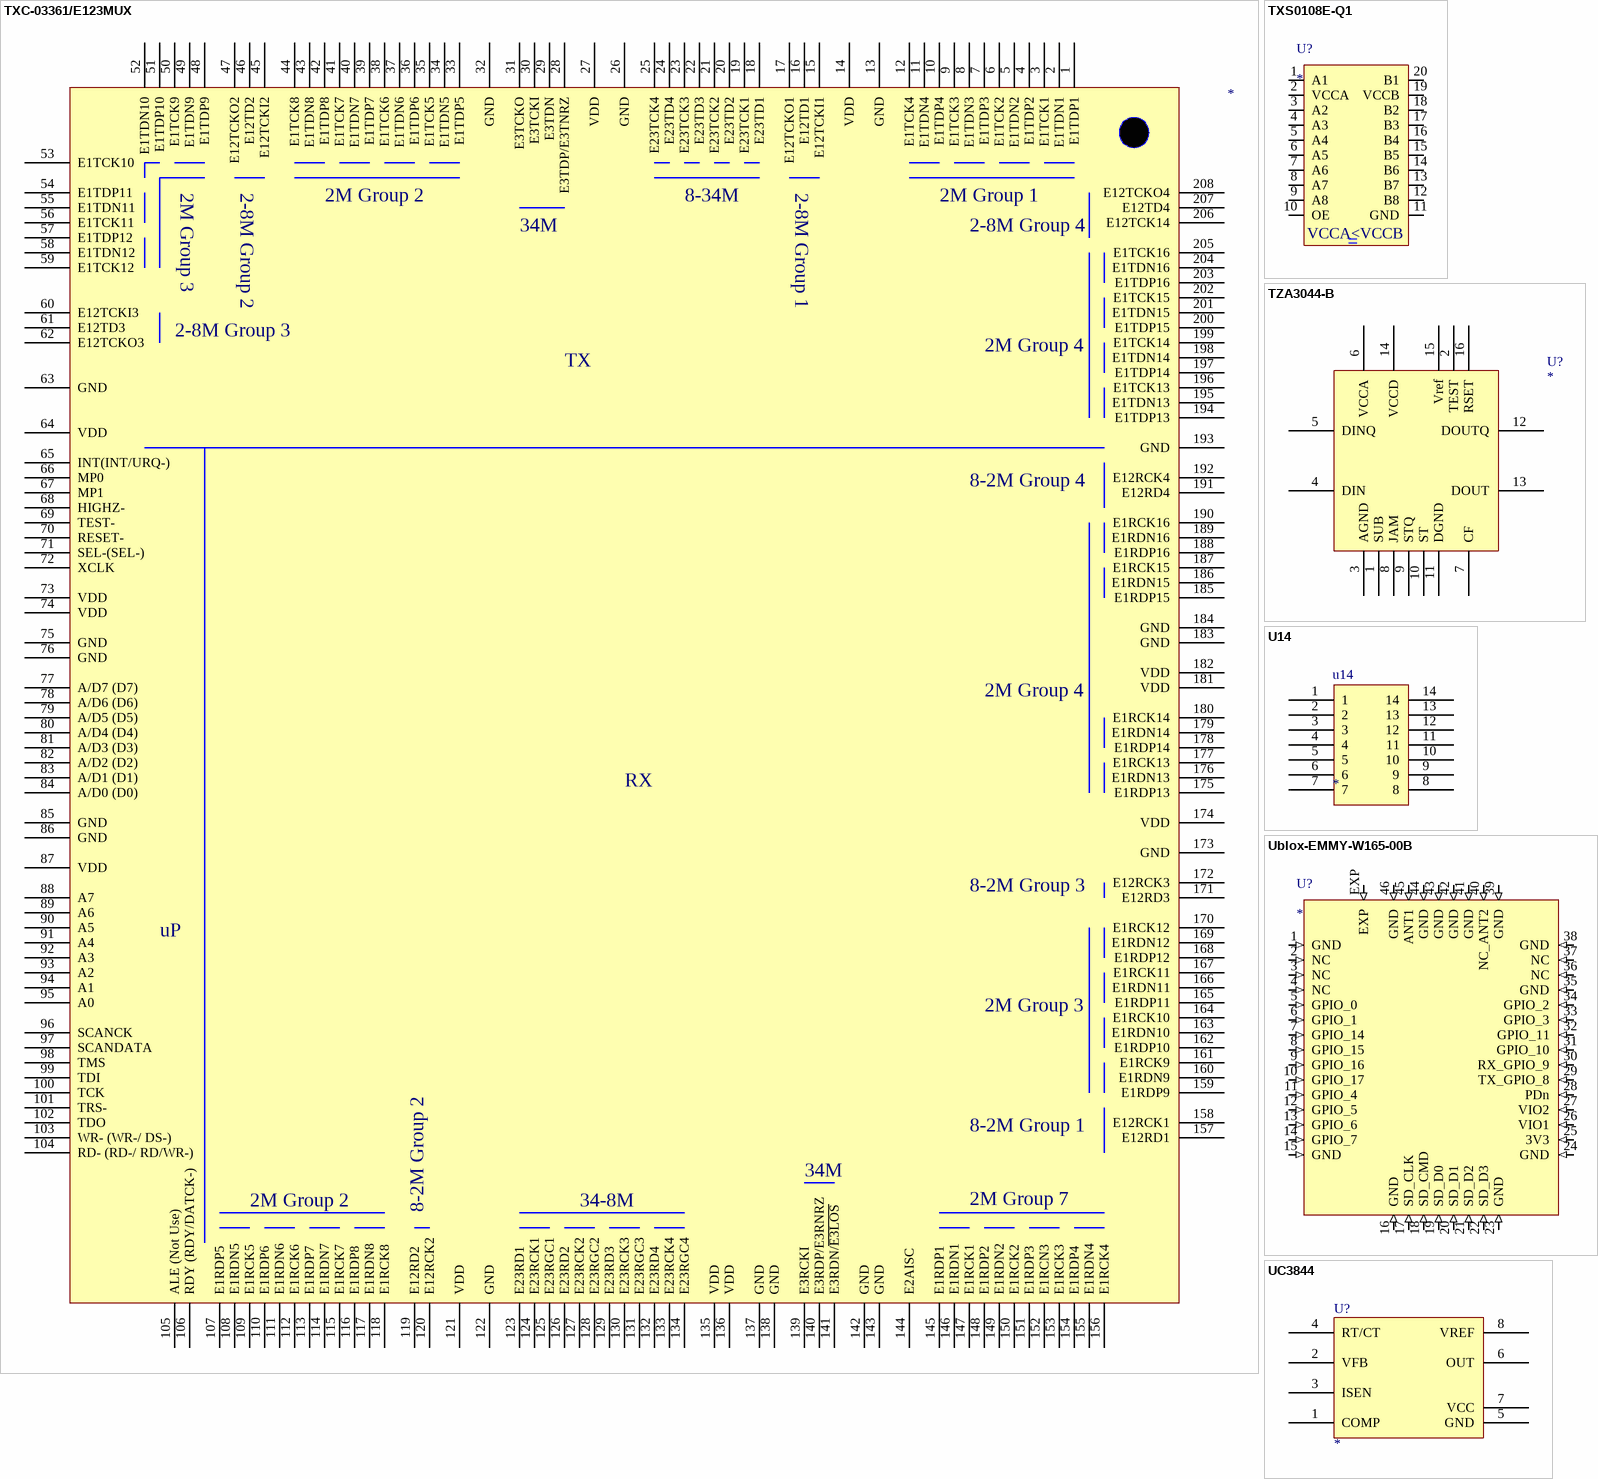
[diagram p79: symbols TXC-03361/E123MUX to UC3844]

## TXC-03361/E123MUX
designator ?
U?
pins: 1 E1TDP1, 2 E1TDN1, 3 E1TCK1, 4 E1TDP2, 5 E1TDN2, 6 E1TCK2, 7 E1TDP3, 8 E1TDN3, 9 E1TCK3, 10 E1TDP4, 11 E1TDN4, 12 E1TCK4, 13 GND (power), 14 VDD (power), 15 E12TCKI1, 16 E12TD1, 17 E12TCKO1, 18 E23TD1, 19 E23TCK1, 20 E23TD2, 21 E23TCK2, 22 E23TD3, 23 E23TCK3, 24 E23TD4, 25 E23TCK4, 26 GND (power), 27 VDD (power), 28 E3TDP/E3TNRZ, 29 E3TDN, 30 E3TCKI, 31 E3TCKO, 32 GND (power), 33 E1TDP5, 34 E1TDN5, 35 E1TCK5, 36 E1TDP6, 37 E1TDN6, 38 E1TCK6, 39 E1TDP7, 40 E1TDN7, 41 E1TCK7, 42 E1TDP8, 43 E1TDN8, 44 E1TCK8, 45 E12TCKI2, 46 E12TD2, 47 E12TCKO2, 48 E1TDP9, 49 E1TDN9, 50 E1TCK9, 51 E1TDP10, 52 E1TDN10, 53 E1TCK10, 54 E1TDP11, 55 E1TDN11, 56 E1TCK11, 57 E1TDP12, 58 E1TDN12, 59 E1TCK12, 60 E12TCKI3, 61 E12TD3, 62 E12TCKO3, 63 GND (power), 64 VDD (power), 65 INT(INT/URQ-), 66 MP0, 67 MP1, 68 HIGHZ-, 69 TEST-, 70 RESET-, 71 SEL-(SEL-), 72 XCLK, 73 VDD (power), 74 VDD (power), 75 GND (power), 76 GND (power), 77 A/D7 (D7), 78 A/D6 (D6), 79 A/D5 (D5), 80 A/D4 (D4), 81 A/D3 (D3), 82 A/D2 (D2), 83 A/D1 (D1), 84 A/D0 (D0), 85 GND (power), 86 GND (power), 87 VDD (power), 88 A7, 89 A6, 90 A5, 91 A4, 92 A3, 93 A2, 94 A1, 95 A0, 96 SCANCK, 97 SCANDATA, 98 TMS, 99 TDI, 100 TCK, 101 TRS-, 102 TDO, 103 WR- (WR-/ DS-), 104 RD- (RD-/ RD/WR-), 105 ALE (Not Use), 106 RDY (RDY/DATCK-), 107 E1RDP5, 108 E1RDN5, 109 E1RCK5, 110 E1RDP6, 111 E1RDN6, 112 E1RCK6, 113 E1RDP7, 114 E1RDN7, 115 E1RCK7, 116 E1RDP8, 117 E1RDN8, 118 E1RCK8, 119 E12RD2, 120 E12RCK2, 121 VDD (power), 122 GND (power), 123 E23RD1, 124 E23RCK1, 125 E23RGC1, 126 E23RD2, 127 E23RCK2, 128 E23RGC2, 129 E23RD3, 130 E23RCK3, 131 E23RGC3, 132 E23RD4, 133 E23RCK4, 134 E23RGC4, 135 VDD (power), 136 VDD (power), 137 GND (power), 138 GND (power), 139 E3RCKI, 140 E3RDP/E3RNRZ, 141 E3RDN/~{E3LOS}, 142 GND (power), 143 GND (power), 144 E2AISC, 145 E1RDP1, 146 E1RDN1, 147 E1RCK1, 148 E1RDP2, 149 E1RDN2, 150 E1RCK2, 151 E1RDP3, 152 E1RCN3, 153 E1RCK3, 154 E1RDP4, 155 E1RDN4, 156 E1RCK4, 157 E12RD1, 158 E12RCK1, 159 E1RDP9, 160 E1RDN9, 161 E1RCK9, 162 E1RDP10, 163 E1RDN10, 164 E1RCK10, 165 E1RDP11, 166 E1RDN11, 167 E1RCK11, 168 E1RDP12, 169 E1RDN12, 170 E1RCK12, 171 E12RD3, 172 E12RCK3, 173 GND (power), 174 VDD (power), 175 E1RDP13, 176 E1RDN13, 177 E1RCK13, 178 E1RDP14, 179 E1RDN14, 180 E1RCK14, 181 VDD (power), 182 VDD (power), 183 GND (power), 184 GND (power), 185 E1RDP15, 186 E1RDN15, 187 E1RCK15, 188 E1RDP16, 189 E1RDN16, 190 E1RCK16, 191 E12RD4, 192 E12RCK4, 193 GND (power), 194 E1TDP13, 195 E1TDN13, 196 E1TCK13, 197 E1TDP14, 198 E1TDN14, 199 E1TCK14, 200 E1TDP15, 201 E1TDN15, 202 E1TCK15, 203 E1TDP16, 204 E1TDN16, 205 E1TCK16, 206 E12TCK14, 207 E12TD4, 208 E12TCKO4
text: 2M Group 3; 2-8M Group 2; 2-8M Group 1; 2M Group 2; 8-34M; 2M Group 1; 34M; 2-8M Group 4; 2-8M Group 3; 2M Group 4; TX; 8-2M Group 4; RX; 8-2M Group 3; uP; 8-2M Group 1; 8-2M Group 2; 34-8M; 2M Group 7

## TXS0108E-Q1
designator U?
footprint TSSOP20B
pins: 1 A1, 2 VCCA, 3 A2, 4 A3, 5 A4, 6 A5, 7 A6, 8 A7, 9 A8, 10 OE, 11 GND, 12 B8, 13 B7, 14 B6, 15 B5, 16 B4, 17 B3, 18 B2, 19 VCCB, 20 B1
text: VCCA<VCCB

## TZA3044-B
designator U?
footprint SO-16
pins: 1 SUB, 2 TEST, 3 AGND, 4 DIN, 5 DINQ, 6 VCCA, 7 CF, 8 JAM, 9 STQ, 10 ST, 11 DGND, 12 DOUTQ, 13 DOUT, 14 VCCD, 15 Vref, 16 RSET

## U14
designator u14
pins: 1, 2, 3, 4, 5, 6, 7, 8, 9, 10, 11, 12, 13, 14

## Ublox-EMMY-W165-00B
designator U?
footprint LLC47 (LCC, 46-Pins, Body 13/80x19/80mmx2/50mm, Pitch 1/25mm, IPC Medium Density)
pins: 1 GND (in), 2 NC (in), 3 NC (in), 4 NC (in), 5 GPIO_0 (in), 6 GPIO_1 (in), 7 GPIO_14 (in), 8 GPIO_15 (in), 9 GPIO_16 (in), 10 GPIO_17 (in), 11 GPIO_4 (in), 12 GPIO_5 (in), 13 GPIO_6 (in), 14 GPIO_7 (in), 15 GND (in), 16 GND (in), 17 SD_CLK (in), 18 SD_CMD (in), 19 SD_D0 (in), 20 SD_D1 (in), 21 SD_D2 (in), 22 SD_D3 (in), 23 GND (in), 24 GND (in), 25 3V3 (in), 26 VIO1 (in), 27 VIO2 (in), 28 PDn (in), 29 TX_GPIO_8 (in), 30 RX_GPIO_9 (in), 31 GPIO_10 (in), 32 GPIO_11 (in), 33 GPIO_3 (in), 34 GPIO_2 (in), 35 GND (in), 36 NC (in), 37 NC (in), 38 GND (in), 39 GND (in), 40 NC_ANT2 (in), 41 GND (in), 42 GND (in), 43 GND (in), 44 GND (in), 45 ANT1 (in), 46 GND (in), EXP (in)

## UC3844
designator U?
pins: 1 COMP, 2 VFB, 3 ISEN, 4 RT/CT, 5 GND (power), 6 OUT, 7 VCC (power), 8 VREF

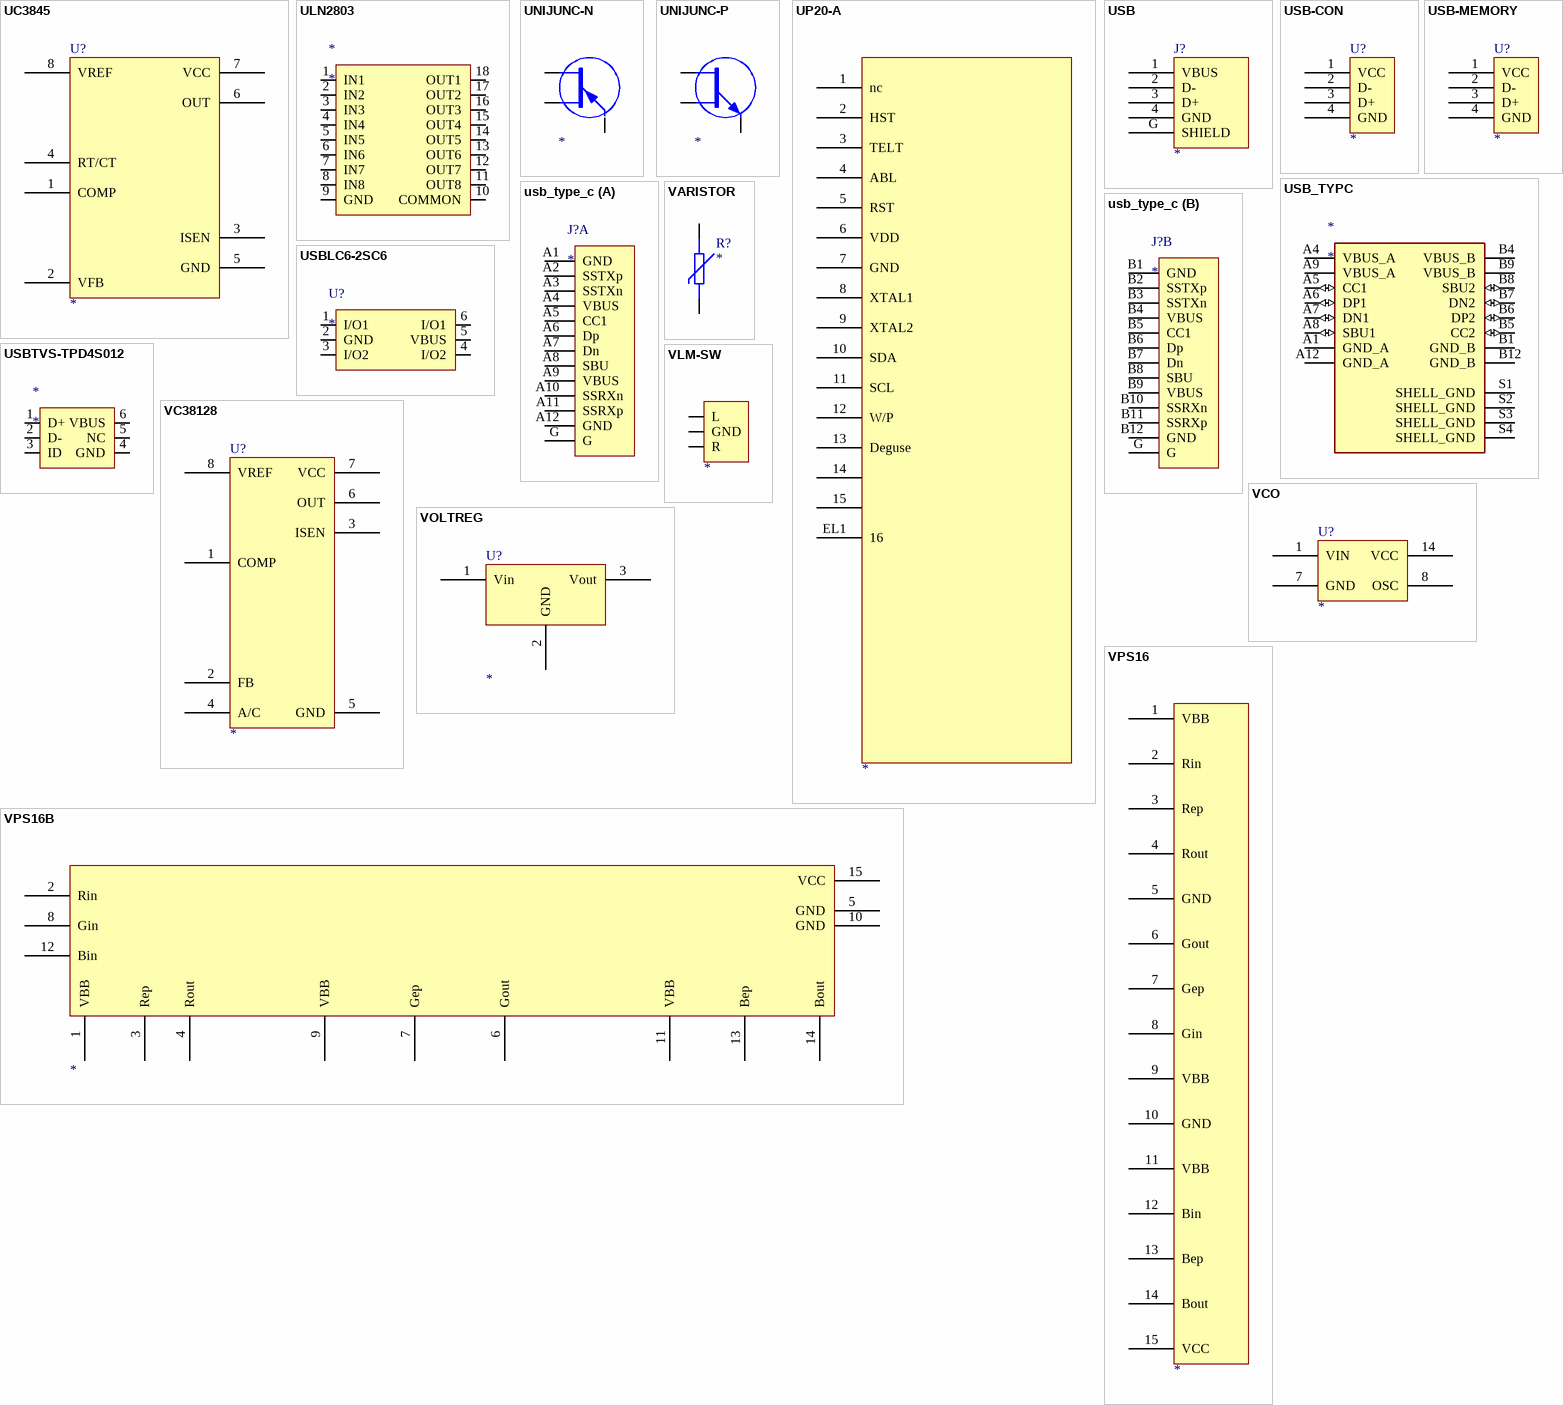
[diagram p80: symbols UC3845 to VPS16B]

## UC3845
designator U?
pins: 1 COMP, 2 VFB, 3 ISEN, 4 RT/CT, 5 GND (power), 6 OUT, 7 VCC (power), 8 VREF

## ULN2803
designator *
footprint SO-18L
pins: 1 IN1, 2 IN2, 3 IN3, 4 IN4, 5 IN5, 6 IN6, 7 IN7, 8 IN8, 9 GND, 10 COMMON, 11 OUT8, 12 OUT7, 13 OUT6, 14 OUT5, 15 OUT4, 16 OUT3, 17 OUT2, 18 OUT1

## UNIJUNC-N
designator ?
pins: 1, 2, 3

## UNIJUNC-P
designator ?
pins: 1, 2, 3

## UP20-A
designator ?
pins: 1 nc, 2 HST, 3 TELT, 4 ABL, 5 RST, 6 VDD, 7 GND, 8 XTAL1, 9 XTAL2, 10 SDA, 11 SCL, 12 W/P, 13 Deguse, 14, 15, EL1 16

## USB
designator J?
footprint USB-F-RA
footprint USB1
footprint USB-M-RA
pins: 1 VBUS, 2 D-, 3 D+, 4 GND, G SHIELD

## USB-CON
designator U?
footprint USB-CON
pins: 1 VCC, 2 D-, 3 D+, 4 GND

## USB-MEMORY
designator U?
footprint USBMODULE
pins: 1 VCC, 2 D-, 3 D+, 4 GND

## USB_TYPC
designator *
pins: A1 GND_A (power), A4 VBUS_A (power), A5 CC1 (io), A6 DP1 (io), A7 DN1 (io), A8 SBU1 (io), A9 VBUS_A (power), A12 GND_A (power), B1 GND_B (power), B4 VBUS_B (power), B5 CC2 (io), B6 DP2 (io), B7 DN2 (io), B8 SBU2 (io), B9 VBUS_B (power), B12 GND_B (power), S1 SHELL_GND (power), S2 SHELL_GND (power), S3 SHELL_GND (power), S4 SHELL_GND (power)

## usb_type_c
designator J?
footprint USB_TYPE_C
part A pins: A1 GND, A2 SSTXp, A3 SSTXn, A4 VBUS, A5 CC1, A6 Dp, A7 Dn, A8 SBU, A9 VBUS, A10 SSRXn, A11 SSRXp, A12 GND, G
part B pins: B1 GND, B2 SSTXp, B3 SSTXn, B4 VBUS, B5 CC1, B6 Dp, B7 Dn, B8 SBU, B9 VBUS, B10 SSRXn, B11 SSRXp, B12 GND, G

## USBLC6-2SC6
designator U?
footprint SOT-25B
pins: 1 I/O1, 2 GND, 3 I/O2, 4 I/O2, 5 VBUS, 6 I/O1

## USBTVS-TPD4S012
designator *
footprint DRY0006A (Footprint not found)
pins: 1 D+, 2 D-, 3 ID, 4 GND, 5 NC, 6 VBUS

## VARISTOR
designator R?
pins: 1, 2

## VC38128
designator U?
pins: 1 COMP, 2 FB, 3 ISEN, 4 A/C, 5 GND, 6 OUT, 7 VCC, 8 VREF

## VCO
designator U?
footprint VCXO-1
pins: 1 VIN, 7 GND, 8 OSC, 14 VCC

## VLM-SW
designator ?
pins: G GND, L, R

## VOLTREG
designator U?
footprint TO-220
pins: 1 Vin, 2 GND, 3 Vout

## VPS16
designator ?
pins: 1 VBB, 2 Rin, 3 Rep, 4 Rout, 5 GND, 6 Gout, 7 Gep, 8 Gin, 9 VBB, 10 GND, 11 VBB, 12 Bin, 13 Bep, 14 Bout, 15 VCC

## VPS16B
designator ?
pins: 1 VBB, 2 Rin, 3 Rep, 4 Rout, 5 GND, 6 Gout, 7 Gep, 8 Gin, 9 VBB, 10 GND, 11 VBB, 12 Bin, 13 Bep, 14 Bout, 15 VCC